# Altium footprint library xcvu351.PcbLib: 27 footprints (part 3 of 4)
Each footprint in its own frame and in the unit in brackets; x right, y up, seen from the top. Pads: shape width x height; smd on the part's side, far side on the other; paste and mask are expansions set on the pad; w line width, h text height; cw(c..) or ccw(c..) is an arc to the next point about the centre after c.
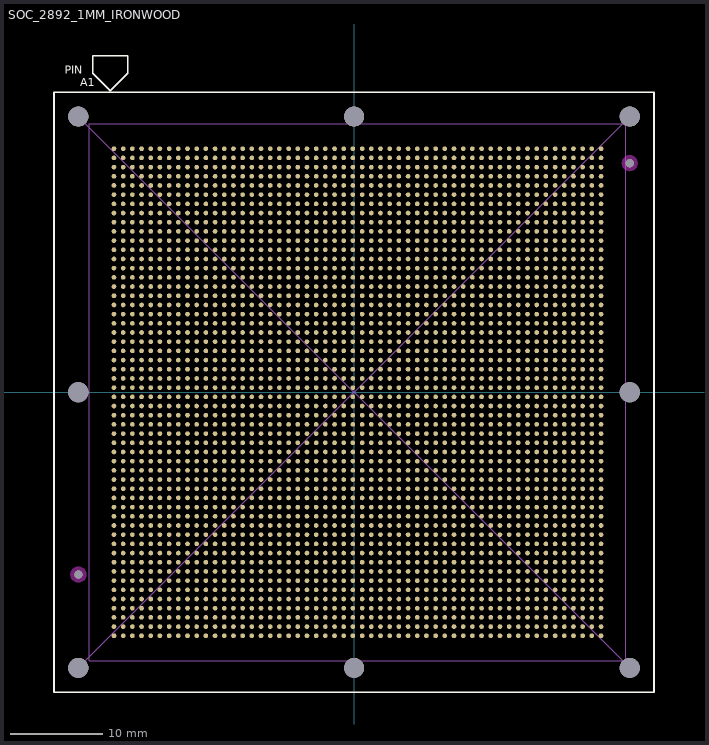
[diagram p2: the footprint, top view; thin cyan lines are the x and y axes]

## SOC_2892_1MM_IRONWOOD [mil] "SOC_2892_1MM_IRONWOOD"
pads (2926):
  round 20 smd: A4(-910.2,1043.31) A5(-870.83,1043.31) A6(-831.46,1043.31) A7(-792.09,1043.31) A8(-752.72,1043.31) A9(-713.35,1043.31) A10(-673.98,1043.31) A11(-634.61,1043.31) A12(-595.24,1043.31) A13(-555.87,1043.31) A14(-516.5,1043.31) A15(-477.13,1043.31) A16(-437.76,1043.31) A17(-398.39,1043.31) A18(-359.02,1043.31) A19(-319.65,1043.31) A20(-280.28,1043.31) A21(-240.91,1043.31) A22(-201.53,1043.31) A23(-162.16,1043.31) A24(-122.8,1043.31) A25(-83.42,1043.31) A26(-44.05,1043.31) A27(-4.68,1043.31) A28(34.69,1043.31) A29(74.06,1043.31) A30(113.42,1043.31) A31(152.79,1043.31) A32(192.16,1043.31) A33(231.53,1043.31) A34(270.91,1043.31) A35(310.28,1043.31) A36(349.65,1043.31) A37(389.02,1043.31) A38(428.39,1043.31) A39(467.76,1043.31) A40(507.13,1043.31) A41(546.5,1043.31) A42(585.87,1043.31) A43(625.24,1043.31) A44(664.61,1043.31) A45(703.98,1043.31) A46(743.35,1043.31) A47(782.72,1043.31) A48(822.09,1043.31) A49(861.46,1043.31) A50(900.83,1043.31) A51(940.2,1043.31) AA1(-1028.31,255.91) AA2(-988.94,255.91) AA3(-949.57,255.91) AA4(-910.2,255.91) AA5(-870.83,255.91) AA6(-831.46,255.91) AA7(-792.09,255.91) AA8(-752.72,255.91) AA9(-713.35,255.91) AA10(-673.98,255.91) AA11(-634.61,255.91) AA12(-595.24,255.91) AA13(-555.87,255.91) AA14(-516.5,255.91) AA15(-477.13,255.91) AA16(-437.76,255.91) AA17(-398.39,255.91) AA18(-359.02,255.91) AA19(-319.65,255.91) AA20(-280.28,255.91) AA21(-240.91,255.91) AA22(-201.53,255.91) AA23(-162.16,255.91) AA24(-122.8,255.91) AA25(-83.42,255.91) AA26(-44.05,255.91) AA27(-4.68,255.91) AA28(34.69,255.91) AA29(74.06,255.91) AA30(113.42,255.91) AA31(152.79,255.91) AA32(192.16,255.91) AA33(231.53,255.91) AA34(270.91,255.91) AA35(310.28,255.91) AA36(349.65,255.91) AA37(389.02,255.91) AA38(428.39,255.91) AA39(467.76,255.91) AA40(507.13,255.91) AA41(546.5,255.91) AA42(585.87,255.91) AA43(625.24,255.91) AA44(664.61,255.91) AA45(703.98,255.91) AA46(743.35,255.91) AA47(782.72,255.91) AA48(822.09,255.91) AA49(861.46,255.91) AA50(900.83,255.91) AA51(940.2,255.91) AA52(979.57,255.91) AA53(1018.94,255.91) AA54(1058.31,255.91) AB1(-1028.31,216.53) AB2(-988.94,216.53) AB3(-949.57,216.53) AB4(-910.2,216.53) AB5(-870.83,216.53) AB6(-831.46,216.53) AB7(-792.09,216.53) AB8(-752.72,216.53) AB9(-713.35,216.53) AB10(-673.98,216.53) AB11(-634.61,216.53) AB12(-595.24,216.53) AB13(-555.87,216.53) AB14(-516.5,216.53) AB15(-477.13,216.53) AB16(-437.76,216.53) AB17(-398.39,216.53) AB18(-359.02,216.53) AB19(-319.65,216.53) AB20(-280.28,216.53) AB21(-240.91,216.53) AB22(-201.53,216.53) AB23(-162.16,216.53) AB24(-122.8,216.53) AB25(-83.42,216.53) AB26(-44.05,216.53) AB27(-4.68,216.53) AB28(34.69,216.53) AB29(74.06,216.53) AB30(113.42,216.53) AB31(152.79,216.53) AB32(192.16,216.53) AB33(231.53,216.53) AB34(270.91,216.53) AB35(310.28,216.53) AB36(349.65,216.53) AB37(389.02,216.53) AB38(428.39,216.53) AB39(467.76,216.53) AB40(507.13,216.53) AB41(546.5,216.53) AB42(585.87,216.53) AB43(625.24,216.53) AB44(664.61,216.53) AB45(703.98,216.53) AB46(743.35,216.53) AB47(782.72,216.53) AB48(822.09,216.53) AB49(861.46,216.53) AB50(900.83,216.53) AB51(940.2,216.53) AB52(979.57,216.53) AB53(1018.94,216.53) AB54(1058.31,216.53) AC1(-1028.31,177.16) AC2(-988.94,177.16) AC3(-949.57,177.16) AC4(-910.2,177.16) AC5(-870.83,177.16) AC6(-831.46,177.16) AC7(-792.09,177.16) AC8(-752.72,177.16) AC9(-713.35,177.16) AC10(-673.98,177.16) AC11(-634.61,177.16) AC12(-595.24,177.16) AC13(-555.87,177.16) AC14(-516.5,177.16) AC15(-477.13,177.16) AC16(-437.76,177.16) AC17(-398.39,177.16) AC18(-359.02,177.16) AC19(-319.65,177.16) AC20(-280.28,177.16) AC21(-240.91,177.16) AC22(-201.53,177.16) AC23(-162.16,177.16) AC24(-122.8,177.16) AC25(-83.42,177.16) AC26(-44.05,177.16) AC27(-4.68,177.16) AC28(34.69,177.16) AC29(74.06,177.16) AC30(113.42,177.16) AC31(152.79,177.16) AC32(192.16,177.16) AC33(231.53,177.16) AC34(270.91,177.16) AC35(310.28,177.16) AC36(349.65,177.16) AC37(389.02,177.16) AC38(428.39,177.16) AC39(467.76,177.16) AC40(507.13,177.16) AC41(546.5,177.16) AC42(585.87,177.16) AC43(625.24,177.16) AC44(664.61,177.16) AC45(703.98,177.16) AC46(743.35,177.16) AC47(782.72,177.16) AC48(822.09,177.16) AC49(861.46,177.16) AC50(900.83,177.16) AC51(940.2,177.16) AC52(979.57,177.16) AC53(1018.94,177.16) AC54(1058.31,177.16) AD1(-1028.31,137.79) AD2(-988.94,137.79) AD3(-949.57,137.79) AD4(-910.2,137.79) AD5(-870.83,137.79) AD6(-831.46,137.79) AD7(-792.09,137.79) AD8(-752.72,137.79) AD9(-713.35,137.79) AD10(-673.98,137.79) AD11(-634.61,137.79) AD12(-595.24,137.79) AD13(-555.87,137.79) AD14(-516.5,137.79) AD15(-477.13,137.79) AD16(-437.76,137.79) AD17(-398.39,137.79) AD18(-359.02,137.79) AD19(-319.65,137.79) AD20(-280.28,137.79) AD21(-240.91,137.79) AD22(-201.53,137.79) AD23(-162.16,137.79) AD24(-122.8,137.79) AD25(-83.42,137.79) AD26(-44.05,137.79) AD27(-4.68,137.79) AD28(34.69,137.79) AD29(74.06,137.79) AD30(113.42,137.79) AD31(152.79,137.79) AD32(192.16,137.79) AD33(231.53,137.79) AD34(270.91,137.79) AD35(310.28,137.79) AD36(349.65,137.79) AD37(389.02,137.79) AD38(428.39,137.79) AD39(467.76,137.79) AD40(507.13,137.79) AD41(546.5,137.79) AD42(585.87,137.79) AD43(625.24,137.79) AD44(664.61,137.79) AD45(703.98,137.79) AD46(743.35,137.79) AD47(782.72,137.79) AD48(822.09,137.79) AD49(861.46,137.79) AD50(900.83,137.79) AD51(940.2,137.79) AD52(979.57,137.79) AD53(1018.94,137.79) AD54(1058.31,137.79) AE1(-1028.31,98.42) AE2(-988.94,98.42) AE3(-949.57,98.42) AE4(-910.2,98.42) AE5(-870.83,98.42) AE6(-831.46,98.42) AE7(-792.09,98.42) AE8(-752.72,98.42) AE9(-713.35,98.42) AE10(-673.98,98.42) AE11(-634.61,98.42) AE12(-595.24,98.42) AE13(-555.87,98.42) AE14(-516.5,98.42) AE15(-477.13,98.42) AE16(-437.76,98.42) AE17(-398.39,98.42) AE18(-359.02,98.42) AE19(-319.65,98.42) AE20(-280.28,98.42) AE21(-240.91,98.42) AE22(-201.53,98.42) AE23(-162.16,98.42) AE24(-122.8,98.42) AE25(-83.42,98.42) AE26(-44.05,98.42) AE27(-4.68,98.42) AE28(34.69,98.42) AE29(74.06,98.42) AE30(113.42,98.42) AE31(152.79,98.42) AE32(192.16,98.42) AE33(231.53,98.42) AE34(270.91,98.42) AE35(310.28,98.42) AE36(349.65,98.42) AE37(389.02,98.42) AE38(428.39,98.42) AE39(467.76,98.42) AE40(507.13,98.42) AE41(546.5,98.42) AE42(585.87,98.42) AE43(625.24,98.42) AE44(664.61,98.42) AE45(703.98,98.42) AE46(743.35,98.42) AE47(782.72,98.42) AE48(822.09,98.42) AE49(861.46,98.42) AE50(900.83,98.42) AE51(940.2,98.42) AE52(979.57,98.42) AE53(1018.94,98.42) AE54(1058.31,98.42) AF1(-1028.31,59.05) AF2(-988.94,59.05) AF3(-949.57,59.05) AF4(-910.2,59.05) AF5(-870.83,59.05) AF6(-831.46,59.05) AF7(-792.09,59.05) AF8(-752.72,59.05) AF9(-713.35,59.05) AF10(-673.98,59.05) AF11(-634.61,59.05) AF12(-595.24,59.05) AF13(-555.87,59.05) AF14(-516.5,59.05) AF15(-477.13,59.05) AF16(-437.76,59.05) AF17(-398.39,59.05) AF18(-359.02,59.05) AF19(-319.65,59.05) AF20(-280.28,59.05) AF21(-240.91,59.05) AF22(-201.53,59.05) AF23(-162.16,59.05) AF24(-122.8,59.05) AF25(-83.42,59.05) AF26(-44.05,59.05) AF27(-4.68,59.05) AF28(34.69,59.05) AF29(74.06,59.05) AF30(113.42,59.05) AF31(152.79,59.05) AF32(192.16,59.05) AF33(231.53,59.05) AF34(270.91,59.05) AF35(310.28,59.05) AF36(349.65,59.05) AF37(389.02,59.05) AF38(428.39,59.05) AF39(467.76,59.05) AF40(507.13,59.05) AF41(546.5,59.05) AF42(585.87,59.05) AF43(625.24,59.05) AF44(664.61,59.05) AF45(703.98,59.05) AF46(743.35,59.05) AF47(782.72,59.05) AF48(822.09,59.05) AF49(861.46,59.05) AF50(900.83,59.05) AF51(940.2,59.05) AF52(979.57,59.05) AF53(1018.94,59.05) AF54(1058.31,59.05) AG1(-1028.31,19.68) AG2(-988.94,19.68) AG3(-949.57,19.68) AG4(-910.2,19.68) AG5(-870.83,19.68) AG6(-831.46,19.68) AG7(-792.09,19.68) AG8(-752.72,19.68) AG9(-713.35,19.68) AG10(-673.98,19.68) AG11(-634.61,19.68) AG12(-595.24,19.68) AG13(-555.87,19.68) AG14(-516.5,19.68) AG15(-477.13,19.68) AG16(-437.76,19.68) AG17(-398.39,19.68) AG18(-359.02,19.68) AG19(-319.65,19.68) AG20(-280.28,19.68) AG21(-240.91,19.68) AG22(-201.53,19.68) AG23(-162.16,19.68) AG24(-122.8,19.68) AG25(-83.42,19.68) AG26(-44.05,19.68) AG27(-4.68,19.68) AG28(34.69,19.68) AG29(74.06,19.68) AG30(113.42,19.68) AG31(152.79,19.68) AG32(192.16,19.68) AG33(231.53,19.68) AG34(270.91,19.68) AG35(310.28,19.68) AG36(349.65,19.68) AG37(389.02,19.68) AG38(428.39,19.68) AG39(467.76,19.68) AG40(507.13,19.68) AG41(546.5,19.68) AG42(585.87,19.68) AG43(625.24,19.68) AG44(664.61,19.68) AG45(703.98,19.68) AG46(743.35,19.68) AG47(782.72,19.68) AG48(822.09,19.68) AG49(861.46,19.68) AG50(900.83,19.68) AG51(940.2,19.68) AG52(979.57,19.68) AG53(1018.94,19.68) AG54(1058.31,19.68) AH1(-1028.31,-19.68) AH2(-988.94,-19.68) AH3(-949.57,-19.68) AH4(-910.2,-19.68) AH5(-870.83,-19.68) AH6(-831.46,-19.68) AH7(-792.09,-19.68) AH8(-752.72,-19.68) AH9(-713.35,-19.68) AH10(-673.98,-19.68) AH11(-634.61,-19.68) AH12(-595.24,-19.68) AH13(-555.87,-19.68) AH14(-516.5,-19.68) AH15(-477.13,-19.68) AH16(-437.76,-19.68) AH17(-398.39,-19.68) AH18(-359.02,-19.68) AH19(-319.65,-19.68) AH20(-280.28,-19.68) AH21(-240.91,-19.68) AH22(-201.53,-19.68) AH23(-162.16,-19.68) AH24(-122.8,-19.68) AH25(-83.42,-19.68) AH26(-44.05,-19.68) AH27(-4.68,-19.68) AH28(34.69,-19.68) AH29(74.06,-19.68) AH30(113.42,-19.68) AH31(152.79,-19.68) AH32(192.16,-19.68) AH33(231.53,-19.68) AH34(270.91,-19.68) AH35(310.28,-19.68) AH36(349.65,-19.68) AH37(389.02,-19.68) AH38(428.39,-19.68) AH39(467.76,-19.68) AH40(507.13,-19.68) AH41(546.5,-19.68) AH42(585.87,-19.68) AH43(625.24,-19.68) AH44(664.61,-19.68) AH45(703.98,-19.68) AH46(743.35,-19.68) AH47(782.72,-19.68) AH48(822.09,-19.68) AH49(861.46,-19.68) AH50(900.83,-19.68) AH51(940.2,-19.68) AH52(979.57,-19.68) AH53(1018.94,-19.68) AH54(1058.31,-19.68) AJ1(-1028.31,-59.05) AJ2(-988.94,-59.05) AJ3(-949.57,-59.05) AJ4(-910.2,-59.05) AJ5(-870.83,-59.05) AJ6(-831.46,-59.05) AJ7(-792.09,-59.05) AJ8(-752.72,-59.05) AJ9(-713.35,-59.05) AJ10(-673.98,-59.05) AJ11(-634.61,-59.05) AJ12(-595.24,-59.05) AJ13(-555.87,-59.05) AJ14(-516.5,-59.05) AJ15(-477.13,-59.05) AJ16(-437.76,-59.05) AJ17(-398.39,-59.05) AJ18(-359.02,-59.05) AJ19(-319.65,-59.05) AJ20(-280.28,-59.05) AJ21(-240.91,-59.05) AJ22(-201.53,-59.05) AJ23(-162.16,-59.05) AJ24(-122.8,-59.05) AJ25(-83.42,-59.05) AJ26(-44.05,-59.05) AJ27(-4.68,-59.05) AJ28(34.69,-59.05) AJ29(74.06,-59.05) AJ30(113.42,-59.05) AJ31(152.79,-59.05) AJ32(192.16,-59.05) AJ33(231.53,-59.05) AJ34(270.91,-59.05) AJ35(310.28,-59.05) AJ36(349.65,-59.05) AJ37(389.02,-59.05) AJ38(428.39,-59.05) AJ39(467.76,-59.05) AJ40(507.13,-59.05) AJ41(546.5,-59.05) AJ42(585.87,-59.05) AJ43(625.24,-59.05) AJ44(664.61,-59.05) AJ45(703.98,-59.05) AJ46(743.35,-59.05) AJ47(782.72,-59.05) AJ48(822.09,-59.05) AJ49(861.46,-59.05) AJ50(900.83,-59.05) AJ51(940.2,-59.05) AJ52(979.57,-59.05) AJ53(1018.94,-59.05) AJ54(1058.31,-59.05) AK1(-1028.31,-98.42) AK2(-988.94,-98.42) AK3(-949.57,-98.42) AK4(-910.2,-98.42) AK5(-870.83,-98.42) AK6(-831.46,-98.42) AK7(-792.09,-98.42) AK8(-752.72,-98.42) AK9(-713.35,-98.42) AK10(-673.98,-98.42) AK11(-634.61,-98.42) AK12(-595.24,-98.42) AK13(-555.87,-98.42) AK14(-516.5,-98.42) AK15(-477.13,-98.42) AK16(-437.76,-98.42) AK17(-398.39,-98.42) AK18(-359.02,-98.42) AK19(-319.65,-98.42) AK20(-280.28,-98.42) AK21(-240.91,-98.42) AK22(-201.53,-98.42) AK23(-162.16,-98.42) AK24(-122.8,-98.42) AK25(-83.42,-98.42) AK26(-44.05,-98.42) AK27(-4.68,-98.42) AK28(34.69,-98.42) AK29(74.06,-98.42) AK30(113.42,-98.42) AK31(152.79,-98.42) AK32(192.16,-98.42) AK33(231.53,-98.42) AK34(270.91,-98.42) AK35(310.28,-98.42) AK36(349.65,-98.42) AK37(389.02,-98.42) AK38(428.39,-98.42) AK39(467.76,-98.42) AK40(507.13,-98.42) AK41(546.5,-98.42) AK42(585.87,-98.42) AK43(625.24,-98.42) AK44(664.61,-98.42) AK45(703.98,-98.42) AK46(743.35,-98.42) AK47(782.72,-98.42) AK48(822.09,-98.42) AK49(861.46,-98.42) AK50(900.83,-98.42) AK51(940.2,-98.42) AK52(979.57,-98.42) AK53(1018.94,-98.42) AK54(1058.31,-98.42) AL1(-1028.31,-137.79) AL2(-988.94,-137.79) AL3(-949.57,-137.79) AL4(-910.2,-137.79) AL5(-870.83,-137.79) AL6(-831.46,-137.79) AL7(-792.09,-137.79) AL8(-752.72,-137.79) AL9(-713.35,-137.79) AL10(-673.98,-137.79) AL11(-634.61,-137.79) AL12(-595.24,-137.79) AL13(-555.87,-137.79) AL14(-516.5,-137.79) AL15(-477.13,-137.79) AL16(-437.76,-137.79) AL17(-398.39,-137.79) AL18(-359.02,-137.79) AL19(-319.65,-137.79) AL20(-280.28,-137.79) AL21(-240.91,-137.79) AL22(-201.53,-137.79) AL23(-162.16,-137.79) AL24(-122.8,-137.79) AL25(-83.42,-137.79) AL26(-44.05,-137.79) AL27(-4.68,-137.79) AL28(34.69,-137.79) AL29(74.06,-137.79) AL30(113.42,-137.79) AL31(152.79,-137.79) AL32(192.16,-137.79) AL33(231.53,-137.79) AL34(270.91,-137.79) AL35(310.28,-137.79) AL36(349.65,-137.79) AL37(389.02,-137.79) AL38(428.39,-137.79) AL39(467.76,-137.79) AL40(507.13,-137.79) AL41(546.5,-137.79) AL42(585.87,-137.79) AL43(625.24,-137.79) AL44(664.61,-137.79) AL45(703.98,-137.79) AL46(743.35,-137.79) AL47(782.72,-137.79) AL48(822.09,-137.79) AL49(861.46,-137.79) AL50(900.83,-137.79) AL51(940.2,-137.79) AL52(979.57,-137.79) AL53(1018.94,-137.79) AL54(1058.31,-137.79) AM1(-1028.31,-177.16) AM2(-988.94,-177.16) AM3(-949.57,-177.16) AM4(-910.2,-177.16) AM5(-870.83,-177.16) AM6(-831.46,-177.16) AM7(-792.09,-177.16) AM8(-752.72,-177.16) AM9(-713.35,-177.16) AM10(-673.98,-177.16) AM11(-634.61,-177.16) AM12(-595.24,-177.16) AM13(-555.87,-177.16) AM14(-516.5,-177.16) AM15(-477.13,-177.16) AM16(-437.76,-177.16) AM17(-398.39,-177.16) AM18(-359.02,-177.16) AM19(-319.65,-177.16) AM20(-280.28,-177.16) AM21(-240.91,-177.16) AM22(-201.53,-177.16) AM23(-162.16,-177.16) AM24(-122.8,-177.16) AM25(-83.42,-177.16) AM26(-44.05,-177.16) AM27(-4.68,-177.16) AM28(34.69,-177.16) AM29(74.06,-177.16) AM30(113.42,-177.16) AM31(152.79,-177.16) AM32(192.16,-177.16) AM33(231.53,-177.16) AM34(270.91,-177.16) AM35(310.28,-177.16) AM36(349.65,-177.16) AM37(389.02,-177.16) AM38(428.39,-177.16) AM39(467.76,-177.16) AM40(507.13,-177.16) AM41(546.5,-177.16) AM42(585.87,-177.16) AM43(625.24,-177.16) AM44(664.61,-177.16) AM45(703.98,-177.16) AM46(743.35,-177.16) AM47(782.72,-177.16) AM48(822.09,-177.16) AM49(861.46,-177.16) AM50(900.83,-177.16) AM51(940.2,-177.16) AM52(979.57,-177.16) AM53(1018.94,-177.16) AM54(1058.31,-177.16) AN1(-1028.31,-216.53) AN2(-988.94,-216.53) AN3(-949.57,-216.53) AN4(-910.2,-216.53) AN5(-870.83,-216.53) AN6(-831.46,-216.53) AN7(-792.09,-216.53) AN8(-752.72,-216.53) AN9(-713.35,-216.53) AN10(-673.98,-216.53) AN11(-634.61,-216.53) AN12(-595.24,-216.53) AN13(-555.87,-216.53) AN14(-516.5,-216.53) AN15(-477.13,-216.53) AN16(-437.76,-216.53) AN17(-398.39,-216.53) AN18(-359.02,-216.53) AN19(-319.65,-216.53) AN20(-280.28,-216.53) AN21(-240.91,-216.53) AN22(-201.53,-216.53) AN23(-162.16,-216.53) AN24(-122.8,-216.53) AN25(-83.42,-216.53) AN26(-44.05,-216.53) AN27(-4.68,-216.53) AN28(34.69,-216.53) AN29(74.06,-216.53) AN30(113.42,-216.53) AN31(152.79,-216.53) AN32(192.16,-216.53) AN33(231.53,-216.53) AN34(270.91,-216.53) AN35(310.28,-216.53) AN36(349.65,-216.53) AN37(389.02,-216.53) AN38(428.39,-216.53) AN39(467.76,-216.53) AN40(507.13,-216.53) AN41(546.5,-216.53) AN42(585.87,-216.53) AN43(625.24,-216.53) AN44(664.61,-216.53) AN45(703.98,-216.53) AN46(743.35,-216.53) AN47(782.72,-216.53) AN48(822.09,-216.53) AN49(861.46,-216.53) AN50(900.83,-216.53) AN51(940.2,-216.53) AN52(979.57,-216.53) AN53(1018.94,-216.53) AN54(1058.31,-216.53) AP1(-1028.31,-255.91) AP2(-988.94,-255.91) AP3(-949.57,-255.91) AP4(-910.2,-255.91) AP5(-870.83,-255.91) AP6(-831.46,-255.91) AP7(-792.09,-255.91) AP8(-752.72,-255.91) AP9(-713.35,-255.91) AP10(-673.98,-255.91) AP11(-634.61,-255.91) AP12(-595.24,-255.91) AP13(-555.87,-255.91) AP14(-516.5,-255.91) AP15(-477.13,-255.91) AP16(-437.76,-255.91) AP17(-398.39,-255.91) AP18(-359.02,-255.91) AP19(-319.65,-255.91) AP20(-280.28,-255.91) AP21(-240.91,-255.91) AP22(-201.53,-255.91) AP23(-162.16,-255.91) AP24(-122.8,-255.91) AP25(-83.42,-255.91) AP26(-44.05,-255.91) AP27(-4.68,-255.91) AP28(34.69,-255.91) AP29(74.06,-255.91) AP30(113.42,-255.91) AP31(152.79,-255.91) AP32(192.16,-255.91) AP33(231.53,-255.91) AP34(270.91,-255.91) AP35(310.28,-255.91) AP36(349.65,-255.91) AP37(389.02,-255.91) AP38(428.39,-255.91) AP39(467.76,-255.91) AP40(507.13,-255.91) AP41(546.5,-255.91) AP42(585.87,-255.91) AP43(625.24,-255.91) AP44(664.61,-255.91) AP45(703.98,-255.91) AP46(743.35,-255.91) AP47(782.72,-255.91) AP48(822.09,-255.91) AP49(861.46,-255.91) AP50(900.83,-255.91) AP51(940.2,-255.91) AP52(979.57,-255.91) AP53(1018.94,-255.91) AP54(1058.31,-255.91) AR1(-1028.31,-295.28) AR2(-988.94,-295.28) AR3(-949.57,-295.28) AR4(-910.2,-295.28) AR5(-870.83,-295.28) AR6(-831.46,-295.28) AR7(-792.09,-295.28) AR8(-752.72,-295.28) AR9(-713.35,-295.28) AR10(-673.98,-295.28) AR11(-634.61,-295.28) AR12(-595.24,-295.28) AR13(-555.87,-295.28) AR14(-516.5,-295.28) AR15(-477.13,-295.28) AR16(-437.76,-295.28) AR17(-398.39,-295.28) AR18(-359.02,-295.28) AR19(-319.65,-295.28) AR20(-280.28,-295.28) AR21(-240.91,-295.28) AR22(-201.53,-295.28) AR23(-162.16,-295.28) AR24(-122.8,-295.28) AR25(-83.42,-295.28) AR26(-44.05,-295.28) AR27(-4.68,-295.28) AR28(34.69,-295.28) AR29(74.06,-295.28) AR30(113.42,-295.28) AR31(152.79,-295.28) AR32(192.16,-295.28) AR33(231.53,-295.28) AR34(270.91,-295.28) AR35(310.28,-295.28) AR36(349.65,-295.28) AR37(389.02,-295.28) AR38(428.39,-295.28) AR39(467.76,-295.28) AR40(507.13,-295.28) AR41(546.5,-295.28) AR42(585.87,-295.28) AR43(625.24,-295.28) AR44(664.61,-295.28) AR45(703.98,-295.28) AR46(743.35,-295.28) AR47(782.72,-295.28) AR48(822.09,-295.28) AR49(861.46,-295.28) AR50(900.83,-295.28) AR51(940.2,-295.28) AR52(979.57,-295.28) AR53(1018.94,-295.28) AR54(1058.31,-295.28) AT1(-1028.31,-334.65) AT2(-988.94,-334.65) AT3(-949.57,-334.65) AT4(-910.2,-334.65) AT5(-870.83,-334.65) AT6(-831.46,-334.65) AT7(-792.09,-334.65) AT8(-752.72,-334.65) AT9(-713.35,-334.65) AT10(-673.98,-334.65) AT11(-634.61,-334.65) AT12(-595.24,-334.65) AT13(-555.87,-334.65) AT14(-516.5,-334.65) AT15(-477.13,-334.65) AT16(-437.76,-334.65) AT17(-398.39,-334.65) AT18(-359.02,-334.65) AT19(-319.65,-334.65) AT20(-280.28,-334.65) AT21(-240.91,-334.65) AT22(-201.53,-334.65) AT23(-162.16,-334.65) AT24(-122.8,-334.65) AT25(-83.42,-334.65) AT26(-44.05,-334.65) AT27(-4.68,-334.65) AT28(34.69,-334.65) AT29(74.06,-334.65) AT30(113.42,-334.65) AT31(152.79,-334.65) AT32(192.16,-334.65) AT33(231.53,-334.65) AT34(270.91,-334.65) AT35(310.28,-334.65) AT36(349.65,-334.65) AT37(389.02,-334.65) AT38(428.39,-334.65) AT39(467.76,-334.65) AT40(507.13,-334.65) AT41(546.5,-334.65) AT42(585.87,-334.65) AT43(625.24,-334.65) AT44(664.61,-334.65) AT45(703.98,-334.65) AT46(743.35,-334.65) AT47(782.72,-334.65) AT48(822.09,-334.65) AT49(861.46,-334.65) AT50(900.83,-334.65) AT51(940.2,-334.65) AT52(979.57,-334.65) AT53(1018.94,-334.65) AT54(1058.31,-334.65) AU1(-1028.31,-374.02) AU2(-988.94,-374.02) AU3(-949.57,-374.02) AU4(-910.2,-374.02) AU5(-870.83,-374.02) AU6(-831.46,-374.02) AU7(-792.09,-374.02) AU8(-752.72,-374.02) AU9(-713.35,-374.02) AU10(-673.98,-374.02) AU11(-634.61,-374.02) AU12(-595.24,-374.02) AU13(-555.87,-374.02) AU14(-516.5,-374.02) AU15(-477.13,-374.02) AU16(-437.76,-374.02) AU17(-398.39,-374.02) AU18(-359.02,-374.02) AU19(-319.65,-374.02) AU20(-280.28,-374.02) AU21(-240.91,-374.02) AU22(-201.53,-374.02) AU23(-162.16,-374.02) AU24(-122.8,-374.02) AU25(-83.42,-374.02) AU26(-44.05,-374.02) AU27(-4.68,-374.02) AU28(34.69,-374.02) AU29(74.06,-374.02) AU30(113.42,-374.02) AU31(152.79,-374.02) AU32(192.16,-374.02) AU33(231.53,-374.02) AU34(270.91,-374.02) AU35(310.28,-374.02) AU36(349.65,-374.02) AU37(389.02,-374.02) AU38(428.39,-374.02) AU39(467.76,-374.02) AU40(507.13,-374.02) AU41(546.5,-374.02) AU42(585.87,-374.02) AU43(625.24,-374.02) AU44(664.61,-374.02) AU45(703.98,-374.02) AU46(743.35,-374.02) AU47(782.72,-374.02) AU48(822.09,-374.02) AU49(861.46,-374.02) AU50(900.83,-374.02) AU51(940.2,-374.02) AU52(979.57,-374.02) AU53(1018.94,-374.02) AU54(1058.31,-374.02) AV1(-1028.31,-413.39) AV2(-988.94,-413.39) AV3(-949.57,-413.39) AV4(-910.2,-413.39) AV5(-870.83,-413.39) AV6(-831.46,-413.39) AV7(-792.09,-413.39) AV8(-752.72,-413.39) AV9(-713.35,-413.39) AV10(-673.98,-413.39) AV11(-634.61,-413.39) AV12(-595.24,-413.39) AV13(-555.87,-413.39) AV14(-516.5,-413.39) AV15(-477.13,-413.39) AV16(-437.76,-413.39) AV17(-398.39,-413.39) AV18(-359.02,-413.39) AV19(-319.65,-413.39) AV20(-280.28,-413.39) AV21(-240.91,-413.39) AV22(-201.53,-413.39) AV23(-162.16,-413.39) AV24(-122.8,-413.39) AV25(-83.42,-413.39) AV26(-44.05,-413.39) AV27(-4.68,-413.39) AV28(34.69,-413.39) AV29(74.06,-413.39) AV30(113.42,-413.39) AV31(152.79,-413.39) AV32(192.16,-413.39) AV33(231.53,-413.39) AV34(270.91,-413.39) AV35(310.28,-413.39) AV36(349.65,-413.39) AV37(389.02,-413.39) AV38(428.39,-413.39) AV39(467.76,-413.39) AV40(507.13,-413.39) AV41(546.5,-413.39) AV42(585.87,-413.39) AV43(625.24,-413.39) AV44(664.61,-413.39) AV45(703.98,-413.39) AV46(743.35,-413.39) AV47(782.72,-413.39) AV48(822.09,-413.39) AV49(861.46,-413.39) AV50(900.83,-413.39) AV51(940.2,-413.39) AV52(979.57,-413.39) AV53(1018.94,-413.39) AV54(1058.31,-413.39) AW1(-1028.31,-452.76) AW2(-988.94,-452.76) AW3(-949.57,-452.76) AW4(-910.2,-452.76) AW5(-870.83,-452.76) AW6(-831.46,-452.76) AW7(-792.09,-452.76) AW8(-752.72,-452.76) AW9(-713.35,-452.76) AW10(-673.98,-452.76) AW11(-634.61,-452.76) AW12(-595.24,-452.76) AW13(-555.87,-452.76) AW14(-516.5,-452.76) AW15(-477.13,-452.76) AW16(-437.76,-452.76) AW17(-398.39,-452.76) AW18(-359.02,-452.76) AW19(-319.65,-452.76) AW20(-280.28,-452.76) AW21(-240.91,-452.76) AW22(-201.53,-452.76) AW23(-162.16,-452.76) AW24(-122.8,-452.76) AW25(-83.42,-452.76) AW26(-44.05,-452.76) AW27(-4.68,-452.76) AW28(34.69,-452.76) AW29(74.06,-452.76) AW30(113.42,-452.76) AW31(152.79,-452.76) AW32(192.16,-452.76) AW33(231.53,-452.76) AW34(270.91,-452.76) AW35(310.28,-452.76) AW36(349.65,-452.76) AW37(389.02,-452.76) AW38(428.39,-452.76) AW39(467.76,-452.76) AW40(507.13,-452.76) AW41(546.5,-452.76) AW42(585.87,-452.76) AW43(625.24,-452.76) AW44(664.61,-452.76) AW45(703.98,-452.76) AW46(743.35,-452.76) AW47(782.72,-452.76) AW48(822.09,-452.76) AW49(861.46,-452.76) AW50(900.83,-452.76) AW51(940.2,-452.76) AW52(979.57,-452.76) AW53(1018.94,-452.76) AW54(1058.31,-452.76) AY1(-1028.31,-492.13) AY2(-988.94,-492.13) AY3(-949.57,-492.13) AY4(-910.2,-492.13) AY5(-870.83,-492.13) AY6(-831.46,-492.13) AY7(-792.09,-492.13) AY8(-752.72,-492.13) AY9(-713.35,-492.13) AY10(-673.98,-492.13) AY11(-634.61,-492.13) AY12(-595.24,-492.13) AY13(-555.87,-492.13) AY14(-516.5,-492.13) AY15(-477.13,-492.13) AY16(-437.76,-492.13) AY17(-398.39,-492.13) AY18(-359.02,-492.13) AY19(-319.65,-492.13) AY20(-280.28,-492.13) AY21(-240.91,-492.13) AY22(-201.53,-492.13) AY23(-162.16,-492.13) AY24(-122.8,-492.13) AY25(-83.42,-492.13) AY26(-44.05,-492.13) AY27(-4.68,-492.13) AY28(34.69,-492.13) AY29(74.06,-492.13) AY30(113.42,-492.13) AY31(152.79,-492.13) AY32(192.16,-492.13) AY33(231.53,-492.13) AY34(270.91,-492.13) AY35(310.28,-492.13) AY36(349.65,-492.13) AY37(389.02,-492.13) AY38(428.39,-492.13) AY39(467.76,-492.13) AY40(507.13,-492.13) AY41(546.5,-492.13) AY42(585.87,-492.13) AY43(625.24,-492.13) AY44(664.61,-492.13) AY45(703.98,-492.13) AY46(743.35,-492.13) AY47(782.72,-492.13) AY48(822.09,-492.13) AY49(861.46,-492.13) AY50(900.83,-492.13) AY51(940.2,-492.13) AY52(979.57,-492.13) AY53(1018.94,-492.13) AY54(1058.31,-492.13) B3(-949.57,1003.94) B4(-910.2,1003.94) B5(-870.83,1003.94) B6(-831.46,1003.94) B7(-792.09,1003.94) B8(-752.72,1003.94) B9(-713.35,1003.94) B10(-673.98,1003.94) B11(-634.61,1003.94) B12(-595.24,1003.94) B13(-555.87,1003.94) B14(-516.5,1003.94) B15(-477.13,1003.94) B16(-437.76,1003.94) B17(-398.39,1003.94) B18(-359.02,1003.94) B19(-319.65,1003.94) B20(-280.28,1003.94) B21(-240.91,1003.94) B22(-201.53,1003.94) B23(-162.16,1003.94) B24(-122.8,1003.94) B25(-83.42,1003.94) B26(-44.05,1003.94) B27(-4.68,1003.94) B28(34.69,1003.94) B29(74.06,1003.94) B30(113.42,1003.94) B31(152.79,1003.94) B32(192.16,1003.94) B33(231.53,1003.94) B34(270.91,1003.94) B35(310.28,1003.94) B36(349.65,1003.94) B37(389.02,1003.94) B38(428.39,1003.94) B39(467.76,1003.94) B40(507.13,1003.94) B41(546.5,1003.94) B42(585.87,1003.94) B43(625.24,1003.94) B44(664.61,1003.94) B45(703.98,1003.94) B46(743.35,1003.94) B47(782.72,1003.94) B48(822.09,1003.94) B49(861.46,1003.94) B50(900.83,1003.94) B51(940.2,1003.94) B52(979.57,1003.94) BA1(-1028.31,-531.5) BA2(-988.94,-531.5) BA3(-949.57,-531.5) BA4(-910.2,-531.5) BA5(-870.83,-531.5) BA6(-831.46,-531.5) BA7(-792.09,-531.5) BA8(-752.72,-531.5) BA9(-713.35,-531.5) BA10(-673.98,-531.5) BA11(-634.61,-531.5) BA12(-595.24,-531.5) BA13(-555.87,-531.5) BA14(-516.5,-531.5) BA15(-477.13,-531.5) BA16(-437.76,-531.5) BA17(-398.39,-531.5) BA18(-359.02,-531.5) BA19(-319.65,-531.5) BA20(-280.28,-531.5) BA21(-240.91,-531.5) BA22(-201.53,-531.5) BA23(-162.16,-531.5) BA24(-122.8,-531.5) BA25(-83.42,-531.5) BA26(-44.05,-531.5) BA27(-4.68,-531.5) BA28(34.69,-531.5) BA29(74.06,-531.5) BA30(113.42,-531.5) BA31(152.79,-531.5) BA32(192.16,-531.5) BA33(231.53,-531.5) BA34(270.91,-531.5) BA35(310.28,-531.5) BA36(349.65,-531.5) BA37(389.02,-531.5) BA38(428.39,-531.5) BA39(467.76,-531.5) BA40(507.13,-531.5) BA41(546.5,-531.5) BA42(585.87,-531.5) BA43(625.24,-531.5) BA44(664.61,-531.5) BA45(703.98,-531.5) BA46(743.35,-531.5) BA47(782.72,-531.5) BA48(822.09,-531.5) BA49(861.46,-531.5) BA50(900.83,-531.5) BA51(940.2,-531.5) BA52(979.57,-531.5) BA53(1018.94,-531.5) BA54(1058.31,-531.5) BB1(-1028.31,-570.87) BB2(-988.94,-570.87) BB3(-949.57,-570.87) BB4(-910.2,-570.87) BB5(-870.83,-570.87) BB6(-831.46,-570.87) BB7(-792.09,-570.87) BB8(-752.72,-570.87) BB9(-713.35,-570.87) BB10(-673.98,-570.87) BB11(-634.61,-570.87) BB12(-595.24,-570.87) BB13(-555.87,-570.87) BB14(-516.5,-570.87) BB15(-477.13,-570.87) BB16(-437.76,-570.87) BB17(-398.39,-570.87) BB18(-359.02,-570.87) BB19(-319.65,-570.87) BB20(-280.28,-570.87) BB21(-240.91,-570.87) BB22(-201.53,-570.87) BB23(-162.16,-570.87) BB24(-122.8,-570.87) BB25(-83.42,-570.87) BB26(-44.05,-570.87) BB27(-4.68,-570.87) BB28(34.69,-570.87) BB29(74.06,-570.87) BB30(113.42,-570.87) BB31(152.79,-570.87) BB32(192.16,-570.87) BB33(231.53,-570.87) BB34(270.91,-570.87) BB35(310.28,-570.87) BB36(349.65,-570.87) BB37(389.02,-570.87) BB38(428.39,-570.87) BB39(467.76,-570.87) BB40(507.13,-570.87) BB41(546.5,-570.87) BB42(585.87,-570.87) BB43(625.24,-570.87) BB44(664.61,-570.87) BB45(703.98,-570.87) BB46(743.35,-570.87) BB47(782.72,-570.87) BB48(822.09,-570.87) BB49(861.46,-570.87) BB50(900.83,-570.87) BB51(940.2,-570.87) BB52(979.57,-570.87) BB53(1018.94,-570.87) BB54(1058.31,-570.87) BC1(-1028.31,-610.24) BC2(-988.94,-610.24) BC3(-949.57,-610.24) BC4(-910.2,-610.24) BC5(-870.83,-610.24) BC6(-831.46,-610.24) BC7(-792.09,-610.24) BC8(-752.72,-610.24) BC9(-713.35,-610.24) BC10(-673.98,-610.24) BC11(-634.61,-610.24) BC12(-595.24,-610.24) BC13(-555.87,-610.24) BC14(-516.5,-610.24) BC15(-477.13,-610.24) BC16(-437.76,-610.24) BC17(-398.39,-610.24) BC18(-359.02,-610.24) BC19(-319.65,-610.24) BC20(-280.28,-610.24) BC21(-240.91,-610.24) BC22(-201.53,-610.24) BC23(-162.16,-610.24) BC24(-122.8,-610.24) BC25(-83.42,-610.24) BC26(-44.05,-610.24) BC27(-4.68,-610.24) BC28(34.69,-610.24) BC29(74.06,-610.24) BC30(113.42,-610.24) BC31(152.79,-610.24) BC32(192.16,-610.24) BC33(231.53,-610.24) BC34(270.91,-610.24) BC35(310.28,-610.24) BC36(349.65,-610.24) BC37(389.02,-610.24) BC38(428.39,-610.24) BC39(467.76,-610.24) BC40(507.13,-610.24) BC41(546.5,-610.24) BC42(585.87,-610.24) BC43(625.24,-610.24) BC44(664.61,-610.24) BC45(703.98,-610.24) BC46(743.35,-610.24) BC47(782.72,-610.24) BC48(822.09,-610.24) BC49(861.46,-610.24) BC50(900.83,-610.24) BC51(940.2,-610.24) BC52(979.57,-610.24) BC53(1018.94,-610.24) BC54(1058.31,-610.24) BD1(-1028.31,-649.61) BD2(-988.94,-649.61) BD3(-949.57,-649.61) BD4(-910.2,-649.61) BD5(-870.83,-649.61) BD6(-831.46,-649.61) BD7(-792.09,-649.61) BD8(-752.72,-649.61) BD9(-713.35,-649.61) BD10(-673.98,-649.61) BD11(-634.61,-649.61) BD12(-595.24,-649.61) BD13(-555.87,-649.61) BD14(-516.5,-649.61) BD15(-477.13,-649.61) BD16(-437.76,-649.61) BD17(-398.39,-649.61) BD18(-359.02,-649.61) BD19(-319.65,-649.61) BD20(-280.28,-649.61) BD21(-240.91,-649.61) BD22(-201.53,-649.61) BD23(-162.16,-649.61) BD24(-122.8,-649.61) BD25(-83.42,-649.61) BD26(-44.05,-649.61) BD27(-4.68,-649.61) BD28(34.69,-649.61) BD29(74.06,-649.61) BD30(113.42,-649.61) BD31(152.79,-649.61) BD32(192.16,-649.61) BD33(231.53,-649.61) BD34(270.91,-649.61) BD35(310.28,-649.61) BD36(349.65,-649.61) BD37(389.02,-649.61) BD38(428.39,-649.61) BD39(467.76,-649.61) BD40(507.13,-649.61) BD41(546.5,-649.61) BD42(585.87,-649.61) BD43(625.24,-649.61) BD44(664.61,-649.61) BD45(703.98,-649.61) BD46(743.35,-649.61) BD47(782.72,-649.61) BD48(822.09,-649.61) BD49(861.46,-649.61) BD50(900.83,-649.61) BD51(940.2,-649.61) BD52(979.57,-649.61) BD53(1018.94,-649.61) BD54(1058.31,-649.61) BE1(-1028.31,-688.98) BE2(-988.94,-688.98) BE3(-949.57,-688.98) BE4(-910.2,-688.98) BE5(-870.83,-688.98) BE6(-831.46,-688.98) BE7(-792.09,-688.98) BE8(-752.72,-688.98) BE9(-713.35,-688.98) BE10(-673.98,-688.98) BE11(-634.61,-688.98) BE12(-595.24,-688.98) BE13(-555.87,-688.98) BE14(-516.5,-688.98) BE15(-477.13,-688.98) BE16(-437.76,-688.98) BE17(-398.39,-688.98) BE18(-359.02,-688.98) BE19(-319.65,-688.98) BE20(-280.28,-688.98) BE21(-240.91,-688.98) BE22(-201.53,-688.98) BE23(-162.16,-688.98) BE24(-122.8,-688.98) BE25(-83.42,-688.98) BE26(-44.05,-688.98) BE27(-4.68,-688.98) BE28(34.69,-688.98) BE29(74.06,-688.98) BE30(113.42,-688.98) BE31(152.79,-688.98) BE32(192.16,-688.98) BE33(231.53,-688.98) BE34(270.91,-688.98) BE35(310.28,-688.98) BE36(349.65,-688.98) BE37(389.02,-688.98) BE38(428.39,-688.98) BE39(467.76,-688.98) BE40(507.13,-688.98) BE41(546.5,-688.98) BE42(585.87,-688.98) BE43(625.24,-688.98) BE44(664.61,-688.98) BE45(703.98,-688.98) BE46(743.35,-688.98) BE47(782.72,-688.98) BE48(822.09,-688.98) BE49(861.46,-688.98) BE50(900.83,-688.98) BE51(940.2,-688.98) BE52(979.57,-688.98) BE53(1018.94,-688.98) BE54(1058.31,-688.98) BF1(-1028.31,-728.35) BF2(-988.94,-728.35) BF3(-949.57,-728.35) BF4(-910.2,-728.35) BF5(-870.83,-728.35) BF6(-831.46,-728.35) BF7(-792.09,-728.35) BF8(-752.72,-728.35) BF9(-713.35,-728.35) BF10(-673.98,-728.35) BF11(-634.61,-728.35) BF12(-595.24,-728.35) BF13(-555.87,-728.35) BF14(-516.5,-728.35) BF15(-477.13,-728.35) BF16(-437.76,-728.35) BF17(-398.39,-728.35) BF18(-359.02,-728.35) BF19(-319.65,-728.35) BF20(-280.28,-728.35) BF21(-240.91,-728.35) BF22(-201.53,-728.35) BF23(-162.16,-728.35) BF24(-122.8,-728.35) BF25(-83.42,-728.35) BF26(-44.05,-728.35) BF27(-4.68,-728.35) BF28(34.69,-728.35) BF29(74.06,-728.35) BF30(113.42,-728.35) BF31(152.79,-728.35) BF32(192.16,-728.35) BF33(231.53,-728.35) BF34(270.91,-728.35) BF35(310.28,-728.35) BF36(349.65,-728.35) BF37(389.02,-728.35) BF38(428.39,-728.35) BF39(467.76,-728.35) BF40(507.13,-728.35) BF41(546.5,-728.35) BF42(585.87,-728.35) BF43(625.24,-728.35) BF44(664.61,-728.35) BF45(703.98,-728.35) BF46(743.35,-728.35) BF47(782.72,-728.35) BF48(822.09,-728.35) BF49(861.46,-728.35) BF50(900.83,-728.35) BF51(940.2,-728.35) BF52(979.57,-728.35) BF53(1018.94,-728.35) BF54(1058.31,-728.35) BG1(-1028.31,-767.72) BG2(-988.94,-767.72) BG3(-949.57,-767.72) BG4(-910.2,-767.72) BG5(-870.83,-767.72) BG6(-831.46,-767.72) BG7(-792.09,-767.72) BG8(-752.72,-767.72) BG9(-713.35,-767.72) BG10(-673.98,-767.72) BG11(-634.61,-767.72) BG12(-595.24,-767.72) BG13(-555.87,-767.72) BG14(-516.5,-767.72) BG15(-477.13,-767.72) BG16(-437.76,-767.72) BG17(-398.39,-767.72) BG18(-359.02,-767.72) BG19(-319.65,-767.72) BG20(-280.28,-767.72) BG21(-240.91,-767.72) BG22(-201.53,-767.72) BG23(-162.16,-767.72) BG24(-122.8,-767.72) BG25(-83.42,-767.72) BG26(-44.05,-767.72) BG27(-4.68,-767.72) BG28(34.69,-767.72) BG29(74.06,-767.72) BG30(113.42,-767.72) BG31(152.79,-767.72) BG32(192.16,-767.72) BG33(231.53,-767.72) BG34(270.91,-767.72) BG35(310.28,-767.72) BG36(349.65,-767.72) BG37(389.02,-767.72) BG38(428.39,-767.72) BG39(467.76,-767.72) BG40(507.13,-767.72) BG41(546.5,-767.72) BG42(585.87,-767.72) BG43(625.24,-767.72) BG44(664.61,-767.72) BG45(703.98,-767.72) BG46(743.35,-767.72) BG47(782.72,-767.72) BG48(822.09,-767.72) BG49(861.46,-767.72) BG50(900.83,-767.72) BG51(940.2,-767.72) BG52(979.57,-767.72) BG53(1018.94,-767.72) BG54(1058.31,-767.72) BH1(-1028.31,-807.09) BH2(-988.94,-807.09) BH3(-949.57,-807.09) BH4(-910.2,-807.09) BH5(-870.83,-807.09) BH6(-831.46,-807.09) BH7(-792.09,-807.09) BH8(-752.72,-807.09) BH9(-713.35,-807.09) BH10(-673.98,-807.09) BH11(-634.61,-807.09) BH12(-595.24,-807.09) BH13(-555.87,-807.09) BH14(-516.5,-807.09) BH15(-477.13,-807.09) BH16(-437.76,-807.09) BH17(-398.39,-807.09) BH18(-359.02,-807.09) BH19(-319.65,-807.09) BH20(-280.28,-807.09) BH21(-240.91,-807.09) BH22(-201.53,-807.09) BH23(-162.16,-807.09) BH24(-122.8,-807.09) BH25(-83.42,-807.09) BH26(-44.05,-807.09) BH27(-4.68,-807.09) BH28(34.69,-807.09) BH29(74.06,-807.09) BH30(113.42,-807.09) BH31(152.79,-807.09) BH32(192.16,-807.09) BH33(231.53,-807.09) BH34(270.91,-807.09) BH35(310.28,-807.09) BH36(349.65,-807.09) BH37(389.02,-807.09) BH38(428.39,-807.09) BH39(467.76,-807.09) BH40(507.13,-807.09) BH41(546.5,-807.09) BH42(585.87,-807.09) BH43(625.24,-807.09) BH44(664.61,-807.09) BH45(703.98,-807.09) BH46(743.35,-807.09) BH47(782.72,-807.09) BH48(822.09,-807.09) BH49(861.46,-807.09) BH50(900.83,-807.09) BH51(940.2,-807.09) BH52(979.57,-807.09) BH53(1018.94,-807.09) BH54(1058.31,-807.09) BJ1(-1028.31,-846.46) BJ2(-988.94,-846.46) BJ3(-949.57,-846.46) BJ4(-910.2,-846.46) BJ5(-870.83,-846.46) BJ6(-831.46,-846.46) BJ7(-792.09,-846.46) BJ8(-752.72,-846.46) BJ9(-713.35,-846.46) BJ10(-673.98,-846.46) BJ11(-634.61,-846.46) BJ12(-595.24,-846.46) BJ13(-555.87,-846.46) BJ14(-516.5,-846.46) BJ15(-477.13,-846.46) BJ16(-437.76,-846.46) BJ17(-398.39,-846.46) BJ18(-359.02,-846.46) BJ19(-319.65,-846.46) BJ20(-280.28,-846.46) BJ21(-240.91,-846.46) BJ22(-201.53,-846.46) BJ23(-162.16,-846.46) BJ24(-122.8,-846.46) BJ25(-83.42,-846.46) BJ26(-44.05,-846.46) BJ27(-4.68,-846.46) BJ28(34.69,-846.46) BJ29(74.06,-846.46) BJ30(113.42,-846.46) BJ31(152.79,-846.46) BJ32(192.16,-846.46) BJ33(231.53,-846.46) BJ34(270.91,-846.46) BJ35(310.28,-846.46) BJ36(349.65,-846.46) BJ37(389.02,-846.46) BJ38(428.39,-846.46) BJ39(467.76,-846.46) BJ40(507.13,-846.46) BJ41(546.5,-846.46) BJ42(585.87,-846.46) BJ43(625.24,-846.46) BJ44(664.61,-846.46) BJ45(703.98,-846.46) BJ46(743.35,-846.46) BJ47(782.72,-846.46) BJ48(822.09,-846.46) BJ49(861.46,-846.46) BJ50(900.83,-846.46) BJ51(940.2,-846.46) BJ52(979.57,-846.46) BJ53(1018.94,-846.46) BJ54(1058.31,-846.46) BK1(-1028.31,-885.83) BK2(-988.94,-885.83) BK3(-949.57,-885.83) BK4(-910.2,-885.83) BK5(-870.83,-885.83) BK6(-831.46,-885.83) BK7(-792.09,-885.83) BK8(-752.72,-885.83) BK9(-713.35,-885.83) BK10(-673.98,-885.83) BK11(-634.61,-885.83) BK12(-595.24,-885.83) BK13(-555.87,-885.83) BK14(-516.5,-885.83) BK15(-477.13,-885.83) BK16(-437.76,-885.83) BK17(-398.39,-885.83) BK18(-359.02,-885.83) BK19(-319.65,-885.83) BK20(-280.28,-885.83) BK21(-240.91,-885.83) BK22(-201.53,-885.83) BK23(-162.16,-885.83) BK24(-122.8,-885.83) BK25(-83.42,-885.83) BK26(-44.05,-885.83) BK27(-4.68,-885.83) BK28(34.69,-885.83) BK29(74.06,-885.83) BK30(113.42,-885.83) BK31(152.79,-885.83) BK32(192.16,-885.83) BK33(231.53,-885.83) BK34(270.91,-885.83) BK35(310.28,-885.83) BK36(349.65,-885.83) BK37(389.02,-885.83) BK38(428.39,-885.83) BK39(467.76,-885.83) BK40(507.13,-885.83) BK41(546.5,-885.83) BK42(585.87,-885.83) BK43(625.24,-885.83) BK44(664.61,-885.83) BK45(703.98,-885.83) BK46(743.35,-885.83) BK47(782.72,-885.83) BK48(822.09,-885.83) BK49(861.46,-885.83) BK50(900.83,-885.83) BK51(940.2,-885.83) BK52(979.57,-885.83) BK53(1018.94,-885.83) BK54(1058.31,-885.83) BL1(-1028.31,-925.2) BL2(-988.94,-925.2) BL3(-949.57,-925.2) BL4(-910.2,-925.2) BL5(-870.83,-925.2) BL6(-831.46,-925.2) BL7(-792.09,-925.2) BL8(-752.72,-925.2) BL9(-713.35,-925.2) BL10(-673.98,-925.2) BL11(-634.61,-925.2) BL12(-595.24,-925.2) BL13(-555.87,-925.2) BL14(-516.5,-925.2) BL15(-477.13,-925.2) BL16(-437.76,-925.2) BL17(-398.39,-925.2) BL18(-359.02,-925.2) BL19(-319.65,-925.2) BL20(-280.28,-925.2) BL21(-240.91,-925.2) BL22(-201.53,-925.2) BL23(-162.16,-925.2) BL24(-122.8,-925.2) BL25(-83.42,-925.2) BL26(-44.05,-925.2) BL27(-4.68,-925.2) BL28(34.69,-925.2) BL29(74.06,-925.2) BL30(113.42,-925.2) BL31(152.79,-925.2) BL32(192.16,-925.2) BL33(231.53,-925.2) BL34(270.91,-925.2) BL35(310.28,-925.2) BL36(349.65,-925.2) BL37(389.02,-925.2) BL38(428.39,-925.2) BL39(467.76,-925.2) BL40(507.13,-925.2) BL41(546.5,-925.2) BL42(585.87,-925.2) BL43(625.24,-925.2) BL44(664.61,-925.2) BL45(703.98,-925.2) BL46(743.35,-925.2) BL47(782.72,-925.2) BL48(822.09,-925.2) BL49(861.46,-925.2) BL50(900.83,-925.2) BL51(940.2,-925.2) BL52(979.57,-925.2) BL53(1018.94,-925.2) BL54(1058.31,-925.2) BM2(-988.94,-964.57) BM3(-949.57,-964.57) BM4(-910.2,-964.57) BM5(-870.83,-964.57) BM6(-831.46,-964.57) BM7(-792.09,-964.57) BM8(-752.72,-964.57) BM9(-713.35,-964.57) BM10(-673.98,-964.57) BM11(-634.61,-964.57) BM12(-595.24,-964.57) BM13(-555.87,-964.57) BM14(-516.5,-964.57) BM15(-477.13,-964.57) BM16(-437.76,-964.57) BM17(-398.39,-964.57) BM18(-359.02,-964.57) BM19(-319.65,-964.57) BM20(-280.28,-964.57) BM21(-240.91,-964.57) BM22(-201.53,-964.57) BM23(-162.16,-964.57) BM24(-122.8,-964.57) BM25(-83.42,-964.57) BM26(-44.05,-964.57) BM27(-4.68,-964.57) BM28(34.69,-964.57) BM29(74.06,-964.57) BM30(113.42,-964.57) BM31(152.79,-964.57) BM32(192.16,-964.57) BM33(231.53,-964.57) BM34(270.91,-964.57) BM35(310.28,-964.57) BM36(349.65,-964.57) BM37(389.02,-964.57) BM38(428.39,-964.57) BM39(467.76,-964.57) BM40(507.13,-964.57) BM41(546.5,-964.57) BM42(585.87,-964.57) BM43(625.24,-964.57) BM44(664.61,-964.57) BM45(703.98,-964.57) BM46(743.35,-964.57) BM47(782.72,-964.57) BM48(822.09,-964.57) BM49(861.46,-964.57) BM50(900.83,-964.57) BM51(940.2,-964.57) BM52(979.57,-964.57) BM53(1018.94,-964.57) BN3(-949.57,-1003.94) BN4(-910.2,-1003.94) BN5(-870.83,-1003.94) BN6(-831.46,-1003.94) BN7(-792.09,-1003.94) BN8(-752.72,-1003.94) BN9(-713.35,-1003.94) BN10(-673.98,-1003.94) BN11(-634.61,-1003.94) BN12(-595.24,-1003.94) BN13(-555.87,-1003.94) BN14(-516.5,-1003.94) BN15(-477.13,-1003.94) BN16(-437.76,-1003.94) BN17(-398.39,-1003.94) BN18(-359.02,-1003.94) BN19(-319.65,-1003.94) BN20(-280.28,-1003.94) BN21(-240.91,-1003.94) BN22(-201.53,-1003.94) BN23(-162.16,-1003.94) BN24(-122.8,-1003.94) BN25(-83.42,-1003.94) BN26(-44.05,-1003.94) BN27(-4.68,-1003.94) BN28(34.69,-1003.94) BN29(74.06,-1003.94) BN30(113.42,-1003.94) BN31(152.79,-1003.94) BN32(192.16,-1003.94) BN33(231.53,-1003.94) BN34(270.91,-1003.94) BN35(310.28,-1003.94) BN36(349.65,-1003.94) BN37(389.02,-1003.94) BN38(428.39,-1003.94) BN39(467.76,-1003.94) BN40(507.13,-1003.94) BN41(546.5,-1003.94) BN42(585.87,-1003.94) BN43(625.24,-1003.94) BN44(664.61,-1003.94) BN45(703.98,-1003.94) BN46(743.35,-1003.94) BN47(782.72,-1003.94) BN48(822.09,-1003.94) BN49(861.46,-1003.94) BN50(900.83,-1003.94) BN51(940.2,-1003.94) BN52(979.57,-1003.94) BP4(-910.2,-1043.31) BP5(-870.83,-1043.31) BP6(-831.46,-1043.31) BP7(-792.09,-1043.31) BP8(-752.72,-1043.31) BP9(-713.35,-1043.31) BP10(-673.98,-1043.31) BP11(-634.61,-1043.31) BP12(-595.24,-1043.31) BP13(-555.87,-1043.31) BP14(-516.5,-1043.31) BP15(-477.13,-1043.31) BP16(-437.76,-1043.31) BP17(-398.39,-1043.31) BP18(-359.02,-1043.31) BP19(-319.65,-1043.31) BP20(-280.28,-1043.31) BP21(-240.91,-1043.31) BP22(-201.53,-1043.31) BP23(-162.16,-1043.31) BP24(-122.8,-1043.31) BP25(-83.42,-1043.31) BP26(-44.05,-1043.31) BP27(-4.68,-1043.31) BP28(34.69,-1043.31) BP29(74.06,-1043.31) BP30(113.42,-1043.31) BP31(152.79,-1043.31) BP32(192.16,-1043.31) BP33(231.53,-1043.31) BP34(270.91,-1043.31) BP35(310.28,-1043.31) BP36(349.65,-1043.31) BP37(389.02,-1043.31) BP38(428.39,-1043.31) BP39(467.76,-1043.31) BP40(507.13,-1043.31) BP41(546.5,-1043.31) BP42(585.87,-1043.31) BP43(625.24,-1043.31) BP44(664.61,-1043.31) BP45(703.98,-1043.31) BP46(743.35,-1043.31) BP47(782.72,-1043.31) BP48(822.09,-1043.31) BP49(861.46,-1043.31) BP50(900.83,-1043.31) BP51(940.2,-1043.31) C2(-988.94,964.57) C3(-949.57,964.57) C4(-910.2,964.57) C5(-870.83,964.57) C6(-831.46,964.57) C7(-792.09,964.57) C8(-752.72,964.57) C9(-713.35,964.57) C10(-673.98,964.57) C11(-634.61,964.57) C12(-595.24,964.57) C13(-555.87,964.57) C14(-516.5,964.57) C15(-477.13,964.57) C16(-437.76,964.57) C17(-398.39,964.57) C18(-359.02,964.57) C19(-319.65,964.57) C20(-280.28,964.57) C21(-240.91,964.57) C22(-201.53,964.57) C23(-162.16,964.57) C24(-122.8,964.57) C25(-83.42,964.57) C26(-44.05,964.57) C27(-4.68,964.57) C28(34.69,964.57) C29(74.06,964.57) C30(113.42,964.57) C31(152.79,964.57) C32(192.16,964.57) C33(231.53,964.57) C34(270.91,964.57) C35(310.28,964.57) C36(349.65,964.57) C37(389.02,964.57) C38(428.39,964.57) C39(467.76,964.57) C40(507.13,964.57) C41(546.5,964.57) C42(585.87,964.57) C43(625.24,964.57) C44(664.61,964.57) C45(703.98,964.57) C46(743.35,964.57) C47(782.72,964.57) C48(822.09,964.57) C49(861.46,964.57) C50(900.83,964.57) C51(940.2,964.57) C52(979.57,964.57) C53(1018.94,964.57) D1(-1028.31,925.2) D2(-988.94,925.2) D3(-949.57,925.2) D4(-910.2,925.2) D5(-870.83,925.2) D6(-831.46,925.2) D7(-792.09,925.2) D8(-752.72,925.2) D9(-713.35,925.2) D10(-673.98,925.2) D11(-634.61,925.2) D12(-595.24,925.2) D13(-555.87,925.2) D14(-516.5,925.2) D15(-477.13,925.2) D16(-437.76,925.2) D17(-398.39,925.2) D18(-359.02,925.2) D19(-319.65,925.2) D20(-280.28,925.2) D21(-240.91,925.2) D22(-201.53,925.2) D23(-162.16,925.2) D24(-122.8,925.2) D25(-83.42,925.2) D26(-44.05,925.2) D27(-4.68,925.2) D28(34.69,925.2) D29(74.06,925.2) D30(113.42,925.2) D31(152.79,925.2) D32(192.16,925.2) D33(231.53,925.2) D34(270.91,925.2) D35(310.28,925.2) D36(349.65,925.2) D37(389.02,925.2) D38(428.39,925.2) D39(467.76,925.2) D40(507.13,925.2) D41(546.5,925.2) D42(585.87,925.2) D43(625.24,925.2) D44(664.61,925.2) D45(703.98,925.2) D46(743.35,925.2) D47(782.72,925.2) D48(822.09,925.2) D49(861.46,925.2) D50(900.83,925.2) D51(940.2,925.2) D52(979.57,925.2) D53(1018.94,925.2) D54(1058.31,925.2) E1(-1028.31,885.83) E2(-988.94,885.83) E3(-949.57,885.83) E4(-910.2,885.83) E5(-870.83,885.83) E6(-831.46,885.83) E7(-792.09,885.83) E8(-752.72,885.83) E9(-713.35,885.83) E10(-673.98,885.83) E11(-634.61,885.83) E12(-595.24,885.83) E13(-555.87,885.83) E14(-516.5,885.83) E15(-477.13,885.83) E16(-437.76,885.83) E17(-398.39,885.83) E18(-359.02,885.83) E19(-319.65,885.83) E20(-280.28,885.83) E21(-240.91,885.83) E22(-201.53,885.83) E23(-162.16,885.83) E24(-122.8,885.83) E25(-83.42,885.83) E26(-44.05,885.83) E27(-4.68,885.83) E28(34.69,885.83) E29(74.06,885.83) E30(113.42,885.83) E31(152.79,885.83) E32(192.16,885.83) E33(231.53,885.83) E34(270.91,885.83) E35(310.28,885.83) E36(349.65,885.83) E37(389.02,885.83) E38(428.39,885.83) E39(467.76,885.83) E40(507.13,885.83) E41(546.5,885.83) E42(585.87,885.83) E43(625.24,885.83) E44(664.61,885.83) E45(703.98,885.83) E46(743.35,885.83) E47(782.72,885.83) E48(822.09,885.83) E49(861.46,885.83) E50(900.83,885.83) E51(940.2,885.83) E52(979.57,885.83) E53(1018.94,885.83) E54(1058.31,885.83) F1(-1028.31,846.46) F2(-988.94,846.46) F3(-949.57,846.46) F4(-910.2,846.46) F5(-870.83,846.46) F6(-831.46,846.46) F7(-792.09,846.46) F8(-752.72,846.46) F9(-713.35,846.46) F10(-673.98,846.46) F11(-634.61,846.46) F12(-595.24,846.46) F13(-555.87,846.46) F14(-516.5,846.46) F15(-477.13,846.46) F16(-437.76,846.46) F17(-398.39,846.46) F18(-359.02,846.46) F19(-319.65,846.46) F20(-280.28,846.46) F21(-240.91,846.46) F22(-201.53,846.46) F23(-162.16,846.46) F24(-122.8,846.46) F25(-83.42,846.46) F26(-44.05,846.46) F27(-4.68,846.46) F28(34.69,846.46) F29(74.06,846.46) F30(113.42,846.46) F31(152.79,846.46) F32(192.16,846.46) F33(231.53,846.46) F34(270.91,846.46) F35(310.28,846.46) F36(349.65,846.46) F37(389.02,846.46) F38(428.39,846.46) F39(467.76,846.46) F40(507.13,846.46) F41(546.5,846.46) F42(585.87,846.46) F43(625.24,846.46) F44(664.61,846.46) F45(703.98,846.46) F46(743.35,846.46) F47(782.72,846.46) F48(822.09,846.46) F49(861.46,846.46) F50(900.83,846.46) F51(940.2,846.46) F52(979.57,846.46) F53(1018.94,846.46) F54(1058.31,846.46) G1(-1028.31,807.09) G2(-988.94,807.09) G3(-949.57,807.09) G4(-910.2,807.09) G5(-870.83,807.09) G6(-831.46,807.09) G7(-792.09,807.09) G8(-752.72,807.09) G9(-713.35,807.09) G10(-673.98,807.09) G11(-634.61,807.09) G12(-595.24,807.09) G13(-555.87,807.09) G14(-516.5,807.09) G15(-477.13,807.09) G16(-437.76,807.09) G17(-398.39,807.09) G18(-359.02,807.09) G19(-319.65,807.09) G20(-280.28,807.09) G21(-240.91,807.09) G22(-201.53,807.09) G23(-162.16,807.09) G24(-122.8,807.09) G25(-83.42,807.09) G26(-44.05,807.09) G27(-4.68,807.09) G28(34.69,807.09) G29(74.06,807.09) G30(113.42,807.09) G31(152.79,807.09) G32(192.16,807.09) G33(231.53,807.09) G34(270.91,807.09) G35(310.28,807.09) G36(349.65,807.09) G37(389.02,807.09) G38(428.39,807.09) G39(467.76,807.09) G40(507.13,807.09) G41(546.5,807.09) G42(585.87,807.09) G43(625.24,807.09) G44(664.61,807.09) G45(703.98,807.09) G46(743.35,807.09) G47(782.72,807.09) G48(822.09,807.09) G49(861.46,807.09) G50(900.83,807.09) G51(940.2,807.09) G52(979.57,807.09) G53(1018.94,807.09) G54(1058.31,807.09) H1(-1028.31,767.72) H2(-988.94,767.72) H3(-949.57,767.72) H4(-910.2,767.72) H5(-870.83,767.72) H6(-831.46,767.72) H7(-792.09,767.72) H8(-752.72,767.72) H9(-713.35,767.72) H10(-673.98,767.72) H11(-634.61,767.72) H12(-595.24,767.72) H13(-555.87,767.72) H14(-516.5,767.72) H15(-477.13,767.72) H16(-437.76,767.72) H17(-398.39,767.72) H18(-359.02,767.72) H19(-319.65,767.72) H20(-280.28,767.72) H21(-240.91,767.72) H22(-201.53,767.72) H23(-162.16,767.72) H24(-122.8,767.72) H25(-83.42,767.72) H26(-44.05,767.72) H27(-4.68,767.72) H28(34.69,767.72) H29(74.06,767.72) H30(113.42,767.72) H31(152.79,767.72) H32(192.16,767.72) H33(231.53,767.72) H34(270.91,767.72) H35(310.28,767.72) H36(349.65,767.72) H37(389.02,767.72) H38(428.39,767.72) H39(467.76,767.72) H40(507.13,767.72) H41(546.5,767.72) H42(585.87,767.72) H43(625.24,767.72) H44(664.61,767.72) H45(703.98,767.72) H46(743.35,767.72) H47(782.72,767.72) H48(822.09,767.72) H49(861.46,767.72) H50(900.83,767.72) H51(940.2,767.72) H52(979.57,767.72) H53(1018.94,767.72) H54(1058.31,767.72) J1(-1028.31,728.35) J2(-988.94,728.35) J3(-949.57,728.35) J4(-910.2,728.35) J5(-870.83,728.35) J6(-831.46,728.35) J7(-792.09,728.35) J8(-752.72,728.35) J9(-713.35,728.35) J10(-673.98,728.35) J11(-634.61,728.35) J12(-595.24,728.35) J13(-555.87,728.35) J14(-516.5,728.35) J15(-477.13,728.35) J16(-437.76,728.35) J17(-398.39,728.35) J18(-359.02,728.35) J19(-319.65,728.35) J20(-280.28,728.35) J21(-240.91,728.35) J22(-201.53,728.35) J23(-162.16,728.35) J24(-122.8,728.35) J25(-83.42,728.35) J26(-44.05,728.35) J27(-4.68,728.35) J28(34.69,728.35) J29(74.06,728.35) J30(113.42,728.35) J31(152.79,728.35) J32(192.16,728.35) J33(231.53,728.35) J34(270.91,728.35) J35(310.28,728.35) J36(349.65,728.35) J37(389.02,728.35) J38(428.39,728.35) J39(467.76,728.35) J40(507.13,728.35) J41(546.5,728.35) J42(585.87,728.35) J43(625.24,728.35) J44(664.61,728.35) J45(703.98,728.35) J46(743.35,728.35) J47(782.72,728.35) J48(822.09,728.35) J49(861.46,728.35) J50(900.83,728.35) J51(940.2,728.35) J52(979.57,728.35) J53(1018.94,728.35) J54(1058.31,728.35) K1(-1028.31,688.98) K2(-988.94,688.98) K3(-949.57,688.98) K4(-910.2,688.98) K5(-870.83,688.98) K6(-831.46,688.98) K7(-792.09,688.98) K8(-752.72,688.98) K9(-713.35,688.98) K10(-673.98,688.98) K11(-634.61,688.98) K12(-595.24,688.98) K13(-555.87,688.98) K14(-516.5,688.98) K15(-477.13,688.98) K16(-437.76,688.98) K17(-398.39,688.98) K18(-359.02,688.98) K19(-319.65,688.98) K20(-280.28,688.98) K21(-240.91,688.98) K22(-201.53,688.98) K23(-162.16,688.98) K24(-122.8,688.98) K25(-83.42,688.98) K26(-44.05,688.98) K27(-4.68,688.98) K28(34.69,688.98) K29(74.06,688.98) K30(113.42,688.98) K31(152.79,688.98) K32(192.16,688.98) K33(231.53,688.98) K34(270.91,688.98) K35(310.28,688.98) K36(349.65,688.98) K37(389.02,688.98) K38(428.39,688.98) K39(467.76,688.98) K40(507.13,688.98) K41(546.5,688.98) K42(585.87,688.98) K43(625.24,688.98) K44(664.61,688.98) K45(703.98,688.98) K46(743.35,688.98) K47(782.72,688.98) K48(822.09,688.98) K49(861.46,688.98) K50(900.83,688.98) K51(940.2,688.98) K52(979.57,688.98) K53(1018.94,688.98) K54(1058.31,688.98) L1(-1028.31,649.61) L2(-988.94,649.61) L3(-949.57,649.61) L4(-910.2,649.61) L5(-870.83,649.61) L6(-831.46,649.61) L7(-792.09,649.61) L8(-752.72,649.61) L9(-713.35,649.61) L10(-673.98,649.61) L11(-634.61,649.61) L12(-595.24,649.61) L13(-555.87,649.61) L14(-516.5,649.61) L15(-477.13,649.61) L16(-437.76,649.61) L17(-398.39,649.61) L18(-359.02,649.61) L19(-319.65,649.61) L20(-280.28,649.61) L21(-240.91,649.61) L22(-201.53,649.61) L23(-162.16,649.61) L24(-122.8,649.61) L25(-83.42,649.61) L26(-44.05,649.61) L27(-4.68,649.61) L28(34.69,649.61) L29(74.06,649.61) L30(113.42,649.61) L31(152.79,649.61) L32(192.16,649.61) L33(231.53,649.61) L34(270.91,649.61) L35(310.28,649.61) L36(349.65,649.61) L37(389.02,649.61) L38(428.39,649.61) L39(467.76,649.61) L40(507.13,649.61) L41(546.5,649.61) L42(585.87,649.61) L43(625.24,649.61) L44(664.61,649.61) L45(703.98,649.61) L46(743.35,649.61) L47(782.72,649.61) L48(822.09,649.61) L49(861.46,649.61) L50(900.83,649.61) L51(940.2,649.61) L52(979.57,649.61) L53(1018.94,649.61) L54(1058.31,649.61) M1(-1028.31,610.24) M2(-988.94,610.24) M3(-949.57,610.24) M4(-910.2,610.24) M5(-870.83,610.24) M6(-831.46,610.24) M7(-792.09,610.24) M8(-752.72,610.24) M9(-713.35,610.24) M10(-673.98,610.24) M11(-634.61,610.24) M12(-595.24,610.24) M13(-555.87,610.24) M14(-516.5,610.24) M15(-477.13,610.24) M16(-437.76,610.24) M17(-398.39,610.24) M18(-359.02,610.24) M19(-319.65,610.24) M20(-280.28,610.24) M21(-240.91,610.24) M22(-201.53,610.24) M23(-162.16,610.24) M24(-122.8,610.24) M25(-83.42,610.24) M26(-44.05,610.24) M27(-4.68,610.24) M28(34.69,610.24) M29(74.06,610.24) M30(113.42,610.24) M31(152.79,610.24) M32(192.16,610.24) M33(231.53,610.24) M34(270.91,610.24) M35(310.28,610.24) M36(349.65,610.24) M37(389.02,610.24) M38(428.39,610.24) M39(467.76,610.24) M40(507.13,610.24) M41(546.5,610.24) M42(585.87,610.24) M43(625.24,610.24) M44(664.61,610.24) M45(703.98,610.24) M46(743.35,610.24) M47(782.72,610.24) M48(822.09,610.24) M49(861.46,610.24) M50(900.83,610.24) M51(940.2,610.24) M52(979.57,610.24) M53(1018.94,610.24) M54(1058.31,610.24) N1(-1028.31,570.87) N2(-988.94,570.87) N3(-949.57,570.87) N4(-910.2,570.87) N5(-870.83,570.87) N6(-831.46,570.87) N7(-792.09,570.87) N8(-752.72,570.87) N9(-713.35,570.87) N10(-673.98,570.87) N11(-634.61,570.87) N12(-595.24,570.87) N13(-555.87,570.87) N14(-516.5,570.87) N15(-477.13,570.87) N16(-437.76,570.87) N17(-398.39,570.87) N18(-359.02,570.87) N19(-319.65,570.87) N20(-280.28,570.87) N21(-240.91,570.87) N22(-201.53,570.87) N23(-162.16,570.87) N24(-122.8,570.87) N25(-83.42,570.87) N26(-44.05,570.87) N27(-4.68,570.87) N28(34.69,570.87) N29(74.06,570.87) N30(113.42,570.87) N31(152.79,570.87) N32(192.16,570.87) N33(231.53,570.87) N34(270.91,570.87) N35(310.28,570.87) N36(349.65,570.87) N37(389.02,570.87) N38(428.39,570.87) N39(467.76,570.87) N40(507.13,570.87) N41(546.5,570.87) N42(585.87,570.87) N43(625.24,570.87) N44(664.61,570.87) N45(703.98,570.87) N46(743.35,570.87) N47(782.72,570.87) N48(822.09,570.87) N49(861.46,570.87) N50(900.83,570.87) N51(940.2,570.87) N52(979.57,570.87) N53(1018.94,570.87) N54(1058.31,570.87) P1(-1028.31,531.5) P2(-988.94,531.5) P3(-949.57,531.5) P4(-910.2,531.5) P5(-870.83,531.5) P6(-831.46,531.5) P7(-792.09,531.5) P8(-752.72,531.5) P9(-713.35,531.5) P10(-673.98,531.5) P11(-634.61,531.5) P12(-595.24,531.5) P13(-555.87,531.5) P14(-516.5,531.5) P15(-477.13,531.5) P16(-437.76,531.5) P17(-398.39,531.5) P18(-359.02,531.5) P19(-319.65,531.5) P20(-280.28,531.5) P21(-240.91,531.5) P22(-201.53,531.5) P23(-162.16,531.5) P24(-122.8,531.5) P25(-83.42,531.5) P26(-44.05,531.5) P27(-4.68,531.5) P28(34.69,531.5) P29(74.06,531.5) P30(113.42,531.5) P31(152.79,531.5) P32(192.16,531.5) P33(231.53,531.5) P34(270.91,531.5) P35(310.28,531.5) P36(349.65,531.5) P37(389.02,531.5) P38(428.39,531.5) P39(467.76,531.5) P40(507.13,531.5) P41(546.5,531.5) P42(585.87,531.5) P43(625.24,531.5) P44(664.61,531.5) P45(703.98,531.5) P46(743.35,531.5) P47(782.72,531.5) P48(822.09,531.5) P49(861.46,531.5) P50(900.83,531.5) P51(940.2,531.5) P52(979.57,531.5) P53(1018.94,531.5) P54(1058.31,531.5) R1(-1028.31,492.13) R2(-988.94,492.13) R3(-949.57,492.13) R4(-910.2,492.13) R5(-870.83,492.13) R6(-831.46,492.13) R7(-792.09,492.13) R8(-752.72,492.13) R9(-713.35,492.13) R10(-673.98,492.13) R11(-634.61,492.13) R12(-595.24,492.13) R13(-555.87,492.13) R14(-516.5,492.13) R15(-477.13,492.13) R16(-437.76,492.13) R17(-398.39,492.13) R18(-359.02,492.13) R19(-319.65,492.13) R20(-280.28,492.13) R21(-240.91,492.13) R22(-201.53,492.13) R23(-162.16,492.13) R24(-122.8,492.13) R25(-83.42,492.13) R26(-44.05,492.13) R27(-4.68,492.13) R28(34.69,492.13) R29(74.06,492.13) R30(113.42,492.13) R31(152.79,492.13) R32(192.16,492.13) R33(231.53,492.13) R34(270.91,492.13) R35(310.28,492.13) R36(349.65,492.13) R37(389.02,492.13) R38(428.39,492.13) R39(467.76,492.13) R40(507.13,492.13) R41(546.5,492.13) R42(585.87,492.13) R43(625.24,492.13) R44(664.61,492.13) R45(703.98,492.13) R46(743.35,492.13) R47(782.72,492.13) R48(822.09,492.13) R49(861.46,492.13) R50(900.83,492.13) R51(940.2,492.13) R52(979.57,492.13) R53(1018.94,492.13) R54(1058.31,492.13) T1(-1028.31,452.76) T2(-988.94,452.76) T3(-949.57,452.76) T4(-910.2,452.76) T5(-870.83,452.76) T6(-831.46,452.76) T7(-792.09,452.76) T8(-752.72,452.76) T9(-713.35,452.76) T10(-673.98,452.76) T11(-634.61,452.76) T12(-595.24,452.76) T13(-555.87,452.76) T14(-516.5,452.76) T15(-477.13,452.76) T16(-437.76,452.76) T17(-398.39,452.76) T18(-359.02,452.76) T19(-319.65,452.76) T20(-280.28,452.76) T21(-240.91,452.76) T22(-201.53,452.76) T23(-162.16,452.76) T24(-122.8,452.76) T25(-83.42,452.76) T26(-44.05,452.76) T27(-4.68,452.76) T28(34.69,452.76) T29(74.06,452.76) T30(113.42,452.76) T31(152.79,452.76) T32(192.16,452.76) T33(231.53,452.76) T34(270.91,452.76) T35(310.28,452.76) T36(349.65,452.76) T37(389.02,452.76) T38(428.39,452.76) T39(467.76,452.76) T40(507.13,452.76) T41(546.5,452.76) T42(585.87,452.76) T43(625.24,452.76) T44(664.61,452.76) T45(703.98,452.76) T46(743.35,452.76) T47(782.72,452.76) T48(822.09,452.76) T49(861.46,452.76) T50(900.83,452.76) T51(940.2,452.76) T52(979.57,452.76) T53(1018.94,452.76) T54(1058.31,452.76) U1(-1028.31,413.39) U2(-988.94,413.39) U3(-949.57,413.39) U4(-910.2,413.39) U5(-870.83,413.39) U6(-831.46,413.39) U7(-792.09,413.39) U8(-752.72,413.39) U9(-713.35,413.39) U10(-673.98,413.39) U11(-634.61,413.39) U12(-595.24,413.39) U13(-555.87,413.39) U14(-516.5,413.39) U15(-477.13,413.39) U16(-437.76,413.39) U17(-398.39,413.39) U18(-359.02,413.39) U19(-319.65,413.39) U20(-280.28,413.39) U21(-240.91,413.39) U22(-201.53,413.39) U23(-162.16,413.39) U24(-122.8,413.39) U25(-83.42,413.39) U26(-44.05,413.39) U27(-4.68,413.39) U28(34.69,413.39) U29(74.06,413.39) U30(113.42,413.39) U31(152.79,413.39) U32(192.16,413.39) U33(231.53,413.39) U34(270.91,413.39) U35(310.28,413.39) U36(349.65,413.39) U37(389.02,413.39) U38(428.39,413.39) U39(467.76,413.39) U40(507.13,413.39) U41(546.5,413.39) U42(585.87,413.39) U43(625.24,413.39) U44(664.61,413.39) U45(703.98,413.39) U46(743.35,413.39) U47(782.72,413.39) U48(822.09,413.39) U49(861.46,413.39) U50(900.83,413.39) U51(940.2,413.39) U52(979.57,413.39) U53(1018.94,413.39) U54(1058.31,413.39) V1(-1028.31,374.02) V2(-988.94,374.02) V3(-949.57,374.02) V4(-910.2,374.02) V5(-870.83,374.02) V6(-831.46,374.02) V7(-792.09,374.02) V8(-752.72,374.02) V9(-713.35,374.02) V10(-673.98,374.02) V11(-634.61,374.02) V12(-595.24,374.02) V13(-555.87,374.02) V14(-516.5,374.02) V15(-477.13,374.02) V16(-437.76,374.02) V17(-398.39,374.02) V18(-359.02,374.02) V19(-319.65,374.02) V20(-280.28,374.02) V21(-240.91,374.02) V22(-201.53,374.02) V23(-162.16,374.02) V24(-122.8,374.02) V25(-83.42,374.02) V26(-44.05,374.02) V27(-4.68,374.02) V28(34.69,374.02) V29(74.06,374.02) V30(113.42,374.02) V31(152.79,374.02) V32(192.16,374.02) V33(231.53,374.02) V34(270.91,374.02) V35(310.28,374.02) V36(349.65,374.02) V37(389.02,374.02) V38(428.39,374.02) V39(467.76,374.02) V40(507.13,374.02) V41(546.5,374.02) V42(585.87,374.02) V43(625.24,374.02) V44(664.61,374.02) V45(703.98,374.02) V46(743.35,374.02) V47(782.72,374.02) V48(822.09,374.02) V49(861.46,374.02) V50(900.83,374.02) V51(940.2,374.02) V52(979.57,374.02) V53(1018.94,374.02) V54(1058.31,374.02) W1(-1028.31,334.65) W2(-988.94,334.65) W3(-949.57,334.65) W4(-910.2,334.65) W5(-870.83,334.65) W6(-831.46,334.65) W7(-792.09,334.65) W8(-752.72,334.65) W9(-713.35,334.65) W10(-673.98,334.65) W11(-634.61,334.65) W12(-595.24,334.65) W13(-555.87,334.65) W14(-516.5,334.65) W15(-477.13,334.65) W16(-437.76,334.65) W17(-398.39,334.65) W18(-359.02,334.65) W19(-319.65,334.65) W20(-280.28,334.65) W21(-240.91,334.65) W22(-201.53,334.65) W23(-162.16,334.65) W24(-122.8,334.65) W25(-83.42,334.65) W26(-44.05,334.65) W27(-4.68,334.65) W28(34.69,334.65) W29(74.06,334.65) W30(113.42,334.65) W31(152.79,334.65) W32(192.16,334.65) W33(231.53,334.65) W34(270.91,334.65) W35(310.28,334.65) W36(349.65,334.65) W37(389.02,334.65) W38(428.39,334.65) W39(467.76,334.65) W40(507.13,334.65) W41(546.5,334.65) W42(585.87,334.65) W43(625.24,334.65) W44(664.61,334.65) W45(703.98,334.65) W46(743.35,334.65) W47(782.72,334.65) W48(822.09,334.65) W49(861.46,334.65) W50(900.83,334.65) W51(940.2,334.65) W52(979.57,334.65) W53(1018.94,334.65) W54(1058.31,334.65) Y1(-1028.31,295.28) Y2(-988.94,295.28) Y3(-949.57,295.28) Y4(-910.2,295.28) Y5(-870.83,295.28) Y6(-831.46,295.28) Y7(-792.09,295.28) Y8(-752.72,295.28) Y9(-713.35,295.28) Y10(-673.98,295.28) Y11(-634.61,295.28) Y12(-595.24,295.28) Y13(-555.87,295.28) Y14(-516.5,295.28) Y15(-477.13,295.28) Y16(-437.76,295.28) Y17(-398.39,295.28) Y18(-359.02,295.28) Y19(-319.65,295.28) Y20(-280.28,295.28) Y21(-240.91,295.28) Y22(-201.53,295.28) Y23(-162.16,295.28) Y24(-122.8,295.28) Y25(-83.42,295.28) Y26(-44.05,295.28) Y27(-4.68,295.28) Y28(34.69,295.28) Y29(74.06,295.28) Y30(113.42,295.28) Y31(152.79,295.28) Y32(192.16,295.28) Y33(231.53,295.28) Y34(270.91,295.28) Y35(310.28,295.28) Y36(349.65,295.28) Y37(389.02,295.28) Y38(428.39,295.28) Y39(467.76,295.28) Y40(507.13,295.28) Y41(546.5,295.28) Y42(585.87,295.28) Y43(625.24,295.28) Y44(664.61,295.28) Y45(703.98,295.28) Y46(743.35,295.28) Y47(782.72,295.28) Y48(822.09,295.28) Y49(861.46,295.28) Y50(900.83,295.28) Y51(940.2,295.28) Y52(979.57,295.28) Y53(1018.94,295.28) Y54(1058.31,295.28) ""(-1028.31,-1043.31) ""(-1028.31,-1003.94) ""(-1028.31,-964.57) ""(-1028.31,964.57) ""(-1028.31,1003.94) ""(-1028.31,1043.31) ""(-988.94,-1043.31) ""(-988.94,-1003.94) ""(-988.94,1003.94) ""(-988.94,1043.31) ""(-949.57,-1043.31) ""(-949.57,1043.31) ""(979.57,-1043.31) ""(979.57,1043.31) ""(1018.94,-1043.31) ""(1018.94,-1003.94) ""(1018.94,1003.94) ""(1018.94,1043.31) ""(1058.31,-1043.31) ""(1058.31,-1003.94) ""(1058.31,-964.57) ""(1058.31,964.57) ""(1058.31,1003.94) ""(1058.31,1043.31)
  round 86 hole 87 unplated: ""(-1180.87,-1181.1) ""(-1180.87,0) ""(-1180.87,1181.1) ""(0.24,-1181.1) ""(0.24,1181.1) ""(1181.34,-1181.1) ""(1181.34,0) ""(1181.34,1181.1)
  round 35 hole 35 unplated: ""(-1180.87,-781.1) ""(1181.34,981.1)
Top Overlay:
  lines w6: -1120,1366.26 -1045,1291.26 -970,1366.26 -970,1441.26 -1120,1441.26 -1120,1366.26
  lines w7.87: -1285,-1285 -1285,1285 1285,1285 1285,-1285 -1285,-1285
  text "PIN" at -1239,1365 h35
  text "A1" at -1172.75,1310.89 h35
Bottom Overlay:
  lines w6: -1045,-885.32 1075,-885.32 ; -1045,-490.31 -709,-490 ; -1045,884.68 1075,884.68 ; -869.68,-1060 -869.68,1060 ; -674.68,1060 -674,700 ; -669,-295 -389,-295 ; -474.69,1060 -474,580 ; 496,100 1075,99.69 ; 505.31,540 505.31,1060 ; 705.32,-1060 705.32,-640 ; 896,295 1075,294.69 ; 900.32,-1060 900.32,1060
  text "A" at -1110.29,1076.63 h35
  text "B" at -1150.29,1046.32 h35
  text "C" at -1110.29,1006.32 h35
  text "D" at -1150.6,966.63 h35
  text "E" at -1110.6,931.63 h35
  text "F" at -1150.6,881.63 h35
  text "G" at -1110.29,846.32 h35
  text "H" at -1150.29,806.32 h35
  text "J" at -1110.29,771.32 h35
  text "K" at -1150.6,726.63 h35
  text "Y" at -1145.6,331.63 h35
  text "W" at -1110.6,371.63 h35
  text "V" at -1145.6,411.63 h35
  text "U" at -1110.6,451.63 h35
  text "T" at -1150.6,486.63 h35
  text "R" at -1110.6,526.63 h35
  text "P" at -1150.6,566.63 h35
  text "N" at -1110.6,606.63 h35
  text "M" at -1150.6,646.63 h35
  text "L" at -1110.6,691.63 h35
  text "AK" at -1128.25,-106.37 h35
  text "AJ" at -1202.94,-67.5 h35
  text "AF" at -1210.25,81.63 h35
  text "AE" at -1150.25,126.63 h35
  text "AD" at -1215.25,166.63 h35
  text "AC" at -1150.25,201.63 h35
  text "AB" at -1215.25,236.63 h35
  text "AA" at -1150.25,271.63 h35
  text "AY" at -1128.25,-496.37 h35
  text "AW" at -1197.94,-452.5 h35
  text "AV" at -1128.25,-416.37 h35
  text "AU" at -1198.25,-371.37 h35
  text "AT" at -1128.25,-336.37 h35
  text "AR" at -1198.25,-291.37 h35
  text "AP" at -1128.25,-266.37 h35
  text "AN" at -1198.25,-221.37 h35
  text "AM" at -1128.25,-186.37 h35
  text "AL" at -1198.25,-146.37 h35
  text "BK" at -1128.25,-896.37 h35
  text "BJ" at -1198.25,-856.37 h35
  text "BH" at -1128.25,-816.37 h35
  text "BG" at -1198.25,-776.37 h35
  text "BF" at -1128.25,-741.37 h35
  text "BE" at -1198.25,-701.37 h35
  text "BD" at -1128.25,-661.37 h35
  text "BC" at -1193.25,-621.37 h35
  text "BB" at -1128.25,-576.37 h35
  text "BA" at -1193.25,-536.37 h35
  text "BL" at -1198.25,-936.37 h35
  text "BM" at -1123.25,-976.37 h35
  text "BN" at -1198.25,-1016.37 h35
  text "BP" at -1119,-1035 h35
  text "1" at -1054,1110 h35
  text "5" at -902.68,1102.68 h35
  text "10" at -714,1155 h35
  text "15" at -512.68,1102.68 h35
  text "20" at -312.69,1102.68 h35
  text "25" at -114.36,1100 h35
  text "30" at 116.69,1097.68 h35
  text "35" at 316.69,1097.68 h35
  text "40" at 516.68,1097.68 h35
  text "45" at 716.68,1097.68 h35
  text "50" at 916.68,1097.68 h35
  text "54" at 1056.68,1097.68 h35
Multi-Layer keep-out:
  region: -1180.87,-815.38 -1171.99,-814.21 -1163.73,-810.79 -1156.63,-805.34 -1151.18,-798.24 -1147.76,-789.97 -1146.59,-781.1 -1147.76,-772.23 -1151.18,-763.96 -1156.63,-756.86 -1163.73,-751.42 -1171.99,-747.99 -1180.87,-746.82 -1189.74,-747.99 -1198.01,-751.42 -1205.1,-756.86 -1210.55,-763.96 -1213.98,-772.23 -1215.14,-781.1 -1213.98,-789.97 -1210.55,-798.24 -1205.1,-805.34 -1198.01,-810.79 -1189.74,-814.21
  region: 1181.34,946.82 1190.21,947.99 1198.48,951.42 1205.58,956.86 1211.02,963.96 1214.45,972.23 1215.62,981.1 1214.45,989.97 1211.02,998.24 1205.58,1005.34 1198.48,1010.79 1190.21,1014.21 1181.34,1015.38 1172.47,1014.21 1164.2,1010.79 1157.1,1005.34 1151.65,998.24 1148.23,989.97 1147.06,981.1 1148.23,972.23 1151.65,963.96 1157.1,956.86 1164.2,951.42 1172.47,947.99
Mechanical55:
  text "AT43" at 625.24,-294.65 h25
  text "AT42" at 585.87,-294.65 h25
  text "AP43" at 625.24,-215.91 h25
  text "AP42" at 585.87,-215.91 h25
  text "AM43" at 625.24,-137.16 h25
  text "AM42" at 585.87,-137.16 h25
  text "AK43" at 625.24,-58.42 h25
  text "AK42" at 585.87,-58.42 h25
  text "AH43" at 625.24,20.32 h25
  text "AH42" at 585.87,20.32 h25
  text "AF43" at 625.24,99.06 h25
  text "AF42" at 585.87,99.06 h25
  text "AD43" at 625.24,177.79 h25
  text "AD42" at 585.87,177.79 h25
  text "AC41" at 546.5,217.16 h25
  text "AC40" at 507.13,217.16 h25
  text "AD47" at 782.72,177.79 h25
  text "AC45" at 703.98,217.16 h25
  text "AB47" at 782.72,256.54 h25
  text "AA49" at 861.46,295.91 h25
  text "AD46" at 743.35,177.79 h25
  text "AC44" at 664.61,217.16 h25
  text "AB46" at 743.35,256.54 h25
  text "AA48" at 822.09,295.91 h25
  text "V43" at 625.24,404.02 h25
  text "V42" at 585.87,404.02 h25
  text "U41" at 546.5,443.39 h25
  text "U40" at 507.13,443.39 h25
  text "P47" at 782.72,561.5 h25
  text "N49" at 861.46,600.87 h25
  text "N45" at 703.98,600.87 h25
  text "M47" at 782.72,640.24 h25
  text "P46" at 743.35,561.5 h25
  text "N48" at 822.09,600.87 h25
  text "N44" at 664.61,600.87 h25
  text "M46" at 743.35,640.24 h25
  text "M43" at 625.24,640.24 h25
  text "M42" at 585.87,640.24 h25
  text "AV12" at -595.24,-373.39 h25
  text "AV13" at -555.87,-373.39 h25
  text "AT12" at -595.24,-294.65 h25
  text "AT13" at -555.87,-294.65 h25
  text "AP12" at -595.24,-215.91 h25
  text "AP13" at -555.87,-215.91 h25
  text "AN14" at -516.5,-176.53 h25
  text "AN15" at -477.13,-176.53 h25
  text "AM12" at -595.24,-137.16 h25
  text "AM13" at -555.87,-137.16 h25
  text "AK12" at -595.24,-58.42 h25
  text "AK13" at -555.87,-58.42 h25
  text "AJ14" at -516.5,-19.05 h25
  text "AJ15" at -477.13,-19.05 h25
  text "AH12" at -595.24,20.32 h25
  text "AH13" at -555.87,20.32 h25
  text "AK8" at -752.72,-68.42 h25
  text "AJ6" at -831.46,-29.05 h25
  text "AJ10" at -673.98,-19.05 h25
  text "AH8" at -752.72,10.31 h25
  text "AK9" at -713.35,-68.42 h25
  text "AJ7" at -792.09,-29.05 h25
  text "AJ11" at -634.61,-19.05 h25
  text "AH9" at -713.35,10.31 h25
  text "AG14" at -516.5,59.69 h25
  text "AG15" at -477.13,59.69 h25
  text "AF12" at -595.24,99.06 h25
  text "AF13" at -555.87,99.06 h25
  text "AG6" at -831.46,49.69 h25
  text "AG10" at -673.98,59.69 h25
  text "AF8" at -752.72,89.06 h25
  text "AE10" at -673.98,138.43 h25
  text "AG7" at -792.09,49.69 h25
  text "AG11" at -634.61,59.69 h25
  text "AF9" at -713.35,89.06 h25
  text "AE11" at -634.61,138.43 h25
  text "AD12" at -595.24,177.79 h25
  text "AD13" at -555.87,177.79 h25
  text "AC14" at -516.5,217.16 h25
  text "AC15" at -477.13,217.16 h25
  text "AD8" at -752.72,167.79 h25
  text "AC10" at -673.98,217.16 h25
  text "AB8" at -752.72,246.53 h25
  text "AA6" at -831.46,285.91 h25
  text "AD9" at -713.35,167.79 h25
  text "AC11" at -634.61,217.16 h25
  text "AB9" at -713.35,246.53 h25
  text "AA7" at -792.09,285.91 h25
  text "AB12" at -595.24,256.54 h25
  text "AB13" at -555.87,256.54 h25
  text "AA14" at -516.5,295.91 h25
  text "AA15" at -477.13,295.91 h25
  text "AA10" at -673.98,295.91 h25
  text "Y8" at -752.72,315.28 h25
  text "W6" at -831.46,354.65 h25
  text "W10" at -673.98,364.65 h25
  text "AA11" at -634.61,295.91 h25
  text "Y9" at -713.35,315.28 h25
  text "W7" at -792.09,354.65 h25
  text "W11" at -634.61,364.65 h25
  text "Y12" at -595.24,325.28 h25
  text "Y13" at -555.87,325.28 h25
  text "W14" at -516.5,364.65 h25
  text "W15" at -477.13,364.65 h25
  text "V8" at -752.72,394.02 h25
  text "U10" at -673.98,443.39 h25
  text "T8" at -752.72,472.76 h25
  text "R10" at -673.98,522.13 h25
  text "V9" at -713.35,394.02 h25
  text "U11" at -634.61,443.39 h25
  text "T9" at -713.35,472.76 h25
  text "R11" at -634.61,522.13 h25
  text "V12" at -595.24,404.02 h25
  text "V13" at -555.87,404.02 h25
  text "U14" at -516.5,443.39 h25
  text "U15" at -477.13,443.39 h25
  text "P8" at -752.72,551.5 h25
  text "N6" at -831.46,590.87 h25
  text "N10" at -673.98,600.87 h25
  text "M8" at -752.72,630.24 h25
  text "P9" at -713.35,551.5 h25
  text "N7" at -792.09,590.87 h25
  text "N11" at -634.61,600.87 h25
  text "M9" at -713.35,630.24 h25
  text "T12" at -595.24,482.76 h25
  text "T13" at -555.87,482.76 h25
  text "R14" at -516.5,522.13 h25
  text "R15" at -477.13,522.13 h25
  text "L6" at -831.46,669.61 h25
  text "L10" at -673.98,679.61 h25
  text "K8" at -752.72,708.98 h25
  text "J6" at -831.46,748.35 h25
  text "L7" at -792.09,669.61 h25
  text "L11" at -634.61,679.61 h25
  text "K9" at -713.35,708.98 h25
  text "J7" at -792.09,748.35 h25
  text "P12" at -595.24,561.5 h25
  text "P13" at -555.87,561.5 h25
  text "M12" at -595.24,640.24 h25
  text "M13" at -555.87,640.24 h25
  text "G6" at -831.46,827.09 h25
  text "E6" at -831.46,905.83 h25
  text "C6" at -831.46,984.57 h25
  text "A5" at -870.83,1063.31 h25
  text "G7" at -792.09,827.09 h25
  text "E7" at -792.09,905.83 h25
  text "C7" at -792.09,984.57 h25
  text "A6" at -831.46,1063.31 h25
  text "BE38" at 428.39,-648.98 h25
  text "BE40" at 507.13,-648.98 h25
  text "BF37" at 389.02,-688.35 h25
  text "BF38" at 428.39,-688.35 h25
  text "BF40" at 507.13,-688.35 h25
  text "BG37" at 389.02,-727.72 h25
  text "BG38" at 428.39,-727.72 h25
  text "BG39" at 467.76,-727.72 h25
  text "BG40" at 507.13,-727.72 h25
  text "BH36" at 349.65,-767.09 h25
  text "BH37" at 389.02,-767.09 h25
  text "BH39" at 467.76,-767.09 h25
  text "BH40" at 507.13,-767.09 h25
  text "BJ36" at 349.65,-806.46 h25
  text "BJ37" at 389.02,-806.46 h25
  text "BJ38" at 428.39,-806.46 h25
  text "BK36" at 349.65,-845.83 h25
  text "BK38" at 428.39,-845.83 h25
  text "BK39" at 467.76,-845.83 h25
  text "BK40" at 507.13,-845.83 h25
  text "BL36" at 349.65,-885.2 h25
  text "BL37" at 389.02,-885.2 h25
  text "BL38" at 428.39,-885.2 h25
  text "BL40" at 507.13,-885.2 h25
  text "BL41" at 546.5,-885.2 h25
  text "BM37" at 389.02,-924.57 h25
  text "BM38" at 428.39,-924.57 h25
  text "BM39" at 467.76,-924.57 h25
  text "BM40" at 507.13,-924.57 h25
  text "BN36" at 349.65,-963.94 h25
  text "BN37" at 389.02,-963.94 h25
  text "BN39" at 467.76,-963.94 h25
  text "BN40" at 507.13,-963.94 h25
  text "BN41" at 546.5,-963.94 h25
  text "BP36" at 349.65,-1003.31 h25
  text "BP37" at 389.02,-1003.31 h25
  text "BP38" at 428.39,-1003.31 h25
  text "BP39" at 467.76,-1003.31 h25
  text "BP41" at 546.5,-1003.31 h25
  text "BF6" at -831.46,-698.35 h25
  text "E16" at -437.76,915.83 h25
  text "F16" at -437.76,876.46 h25
  text "K16" at -437.76,718.98 h25
  text "K17" at -398.39,718.98 h25
  text "L18" at -359.02,679.61 h25
  text "L19" at -319.65,679.61 h25
  text "L20" at -280.28,679.61 h25
  text "L21" at -240.91,679.61 h25
  text "K18" at -359.02,718.98 h25
  text "K19" at -319.65,718.98 h25
  text "J16" at -437.76,758.35 h25
  text "C20" at -280.28,994.57 h25
  text "C19" at -319.65,994.57 h25
  text "L24" at -122.8,679.61 h25
  text "L25" at -83.42,679.61 h25
  text "K26" at -44.05,718.98 h25
  text "L26" at -44.05,679.61 h25
  text "H25" at -83.42,797.72 h25
  text "C27" at -4.68,994.57 h25
  text "C22" at -201.53,994.57 h25
  text "G46" at 743.35,837.09 h25
  text "B43" at 625.24,1033.94 h25
  text "C42" at 585.87,994.57 h25
  text "BE16" at -437.76,-648.98 h25
  text "BE18" at -359.02,-648.98 h25
  text "BF17" at -398.39,-688.35 h25
  text "BF18" at -359.02,-688.35 h25
  text "BF20" at -280.28,-688.35 h25
  text "BG17" at -398.39,-727.72 h25
  text "BG18" at -359.02,-727.72 h25
  text "BG19" at -319.65,-727.72 h25
  text "BG20" at -280.28,-727.72 h25
  text "BH16" at -437.76,-767.09 h25
  text "BH17" at -398.39,-767.09 h25
  text "BH19" at -319.65,-767.09 h25
  text "BH20" at -280.28,-767.09 h25
  text "BJ16" at -437.76,-806.46 h25
  text "BJ17" at -398.39,-806.46 h25
  text "BJ18" at -359.02,-806.46 h25
  text "BK16" at -437.76,-845.83 h25
  text "BK18" at -359.02,-845.83 h25
  text "BK19" at -319.65,-845.83 h25
  text "BK20" at -280.28,-845.83 h25
  text "BL16" at -437.76,-885.2 h25
  text "BL17" at -398.39,-885.2 h25
  text "BL18" at -359.02,-885.2 h25
  text "BL20" at -280.28,-885.2 h25
  text "BL21" at -240.91,-885.2 h25
  text "BM17" at -398.39,-924.57 h25
  text "BM18" at -359.02,-924.57 h25
  text "BM19" at -319.65,-924.57 h25
  text "BM20" at -280.28,-924.57 h25
  text "BN16" at -437.76,-963.94 h25
  text "BN17" at -398.39,-963.94 h25
  text "BN19" at -319.65,-963.94 h25
  text "BN20" at -280.28,-963.94 h25
  text "BN21" at -240.91,-963.94 h25
  text "BP16" at -437.76,-1003.31 h25
  text "BP17" at -398.39,-1003.31 h25
  text "BP18" at -359.02,-1003.31 h25
  text "BP19" at -319.65,-1003.31 h25
  text "BP21" at -240.91,-1003.31 h25
  text "AY41" at 546.5,-452.13 h25
  text "AY42" at 585.87,-452.13 h25
  text "BA41" at 546.5,-491.5 h25
  text "BA42" at 585.87,-491.5 h25
  text "BB41" at 546.5,-530.87 h25
  text "BB42" at 585.87,-530.87 h25
  text "BM29" at 74.06,-924.57 h25
  text "BB14" at -516.5,-530.87 h25
  text "BB15" at -477.13,-530.87 h25
  text "BA15" at -477.13,-491.5 h25
  text "BA13" at -555.87,-491.5 h25
  text "BB13" at -555.87,-530.87 h25
  text "BF15" at -477.13,-688.35 h25
  text "C46" at 743.35,994.57 h25
  text "BF4" at -910.2,-698.35 h25
  text "AM7" at -792.09,-147.16 h25
  text "J5" at -870.83,748.35 h25
  text "J4" at -910.2,748.35 h25
  text "J1" at -1028.31,748.35 h25
  text "J2" at -988.94,748.35 h25
  text "J3" at -949.57,748.35 h25
  text "A4" at -910.2,1063.31 h25
  text "A7" at -792.09,1063.31 h25
  text "A12" at -595.24,1073.31 h25
  text "A17" at -398.39,1073.31 h25
  text "A22" at -201.53,1073.31 h25
  text "A27" at -4.68,1073.31 h25
  text "A32" at 192.16,1073.31 h25
  text "A37" at 389.02,1073.31 h25
  text "A42" at 585.87,1073.31 h25
  text "A47" at 782.72,1073.31 h25
  text "A48" at 822.09,1073.31 h25
  text "A51" at 940.2,1073.31 h25
  text "B3" at -949.57,1023.94 h25
  text "B4" at -910.2,1023.94 h25
  text "B5" at -870.83,1023.94 h25
  text "B6" at -831.46,1023.94 h25
  text "B7" at -792.09,1023.94 h25
  text "B8" at -752.72,1023.94 h25
  text "B9" at -713.35,1023.94 h25
  text "B14" at -516.5,1033.94 h25
  text "B19" at -319.65,1033.94 h25
  text "B24" at -122.8,1033.94 h25
  text "B29" at 74.06,1033.94 h25
  text "B34" at 270.91,1033.94 h25
  text "B39" at 467.76,1033.94 h25
  text "B44" at 664.61,1033.94 h25
  text "B47" at 782.72,1033.94 h25
  text "B48" at 822.09,1033.94 h25
  text "B49" at 861.46,1033.94 h25
  text "B50" at 900.83,1033.94 h25
  text "B51" at 940.2,1033.94 h25
  text "B52" at 979.57,1033.94 h25
  text "C2" at -988.94,984.57 h25
  text "C3" at -949.57,984.57 h25
  text "C4" at -910.2,984.57 h25
  text "C5" at -870.83,984.57 h25
  text "C8" at -752.72,984.57 h25
  text "C11" at -634.61,994.57 h25
  text "C16" at -437.76,994.57 h25
  text "C21" at -240.91,994.57 h25
  text "C26" at -44.05,994.57 h25
  text "C31" at 152.79,994.57 h25
  text "C36" at 349.65,994.57 h25
  text "C41" at 546.5,994.57 h25
  text "C47" at 782.72,994.57 h25
  text "C50" at 900.83,994.57 h25
  text "C51" at 940.2,994.57 h25
  text "C52" at 979.57,994.57 h25
  text "C53" at 1018.94,994.57 h25
  text "D1" at -1028.31,945.2 h25
  text "D2" at -988.94,945.2 h25
  text "D3" at -949.57,945.2 h25
  text "D4" at -910.2,945.2 h25
  text "D5" at -870.83,945.2 h25
  text "D6" at -831.46,945.2 h25
  text "D8" at -752.72,945.2 h25
  text "D13" at -555.87,955.2 h25
  text "D18" at -359.02,955.2 h25
  text "D23" at -162.16,955.2 h25
  text "D28" at 34.69,955.2 h25
  text "D33" at 231.53,955.2 h25
  text "D38" at 428.39,955.2 h25
  text "D43" at 625.24,955.2 h25
  text "D47" at 782.72,955.2 h25
  text "D49" at 861.46,955.2 h25
  text "D50" at 900.83,955.2 h25
  text "D54" at 1058.31,955.2 h25
  text "E1" at -1028.31,905.83 h25
  text "E2" at -988.94,905.83 h25
  text "E3" at -949.57,905.83 h25
  text "E4" at -910.2,905.83 h25
  text "E5" at -870.83,905.83 h25
  text "E8" at -752.72,905.83 h25
  text "E10" at -673.98,915.83 h25
  text "E15" at -477.13,915.83 h25
  text "E20" at -280.28,915.83 h25
  text "E25" at -83.42,915.83 h25
  text "E35" at 310.28,915.83 h25
  text "E45" at 703.98,915.83 h25
  text "E47" at 782.72,915.83 h25
  text "E50" at 900.83,915.83 h25
  text "E51" at 940.2,915.83 h25
  text "E52" at 979.57,915.83 h25
  text "F1" at -1028.31,866.46 h25
  text "F2" at -988.94,866.46 h25
  text "F3" at -949.57,866.46 h25
  text "F4" at -910.2,866.46 h25
  text "F5" at -870.83,866.46 h25
  text "F6" at -831.46,866.46 h25
  text "F8" at -752.72,866.46 h25
  text "F12" at -595.24,876.46 h25
  text "F22" at -201.53,876.46 h25
  text "F32" at 192.16,876.46 h25
  text "F37" at 389.02,876.46 h25
  text "F42" at 585.87,876.46 h25
  text "F47" at 782.72,876.46 h25
  text "F49" at 861.46,876.46 h25
  text "F50" at 900.83,876.46 h25
  text "F53" at 1018.94,876.46 h25
  text "F54" at 1058.31,876.46 h25
  text "G1" at -1028.31,827.09 h25
  text "G2" at -988.94,827.09 h25
  text "G3" at -949.57,827.09 h25
  text "G4" at -910.2,827.09 h25
  text "G5" at -870.83,827.09 h25
  text "G8" at -752.72,827.09 h25
  text "G9" at -713.35,827.09 h25
  text "G19" at -319.65,837.09 h25
  text "G29" at 74.06,837.09 h25
  text "G39" at 467.76,837.09 h25
  text "G47" at 782.72,837.09 h25
  text "G50" at 900.83,837.09 h25
  text "G51" at 940.2,837.09 h25
  text "G52" at 979.57,837.09 h25
  text "H1" at -1028.31,787.72 h25
  text "H2" at -988.94,787.72 h25
  text "H3" at -949.57,787.72 h25
  text "H4" at -910.2,787.72 h25
  text "H5" at -870.83,787.72 h25
  text "H6" at -831.46,787.72 h25
  text "H8" at -752.72,787.72 h25
  text "H16" at -437.76,797.72 h25
  text "H26" at -44.05,797.72 h25
  text "H36" at 349.65,797.72 h25
  text "H46" at 743.35,797.72 h25
  text "H47" at 782.72,797.72 h25
  text "H49" at 861.46,797.72 h25
  text "H50" at 900.83,797.72 h25
  text "H53" at 1018.94,797.72 h25
  text "H54" at 1058.31,797.72 h25
  text "J8" at -752.72,748.35 h25
  text "J9" at -713.35,748.35 h25
  text "J10" at -673.98,758.35 h25
  text "J13" at -555.87,758.35 h25
  text "J23" at -162.16,758.35 h25
  text "J33" at 231.53,758.35 h25
  text "J43" at 625.24,758.35 h25
  text "J45" at 703.98,758.35 h25
  text "J46" at 743.35,758.35 h25
  text "J47" at 782.72,758.35 h25
  text "J50" at 900.83,758.35 h25
  text "J51" at 940.2,758.35 h25
  text "J52" at 979.57,758.35 h25
  text "K1" at -1028.31,708.98 h25
  text "K2" at -988.94,708.98 h25
  text "K3" at -949.57,708.98 h25
  text "K4" at -910.2,708.98 h25
  text "K5" at -870.83,708.98 h25
  text "K6" at -831.46,708.98 h25
  text "K10" at -673.98,718.98 h25
  text "K11" at -634.61,718.98 h25
  text "K12" at -595.24,718.98 h25
  text "K20" at -280.28,718.98 h25
  text "K30" at 113.42,718.98 h25
  text "K40" at 507.13,718.98 h25
  text "K43" at 625.24,718.98 h25
  text "K44" at 664.61,718.98 h25
  text "K45" at 703.98,718.98 h25
  text "K49" at 861.46,718.98 h25
  text "K50" at 900.83,718.98 h25
  text "K53" at 1018.94,718.98 h25
  text "K54" at 1058.31,718.98 h25
  text "L1" at -1028.31,669.61 h25
  text "L2" at -988.94,669.61 h25
  text "L3" at -949.57,669.61 h25
  text "L4" at -910.2,669.61 h25
  text "L5" at -870.83,669.61 h25
  text "L8" at -752.72,669.61 h25
  text "L12" at -595.24,679.61 h25
  text "L13" at -555.87,679.61 h25
  text "L14" at -516.5,679.61 h25
  text "L17" at -398.39,679.61 h25
  text "L22" at -201.53,679.61 h25
  text "L27" at -4.68,679.61 h25
  text "L32" at 192.16,679.61 h25
  text "L37" at 389.02,679.61 h25
  text "L41" at 546.5,679.61 h25
  text "L42" at 585.87,679.61 h25
  text "L43" at 625.24,679.61 h25
  text "L47" at 782.72,679.61 h25
  text "L50" at 900.83,679.61 h25
  text "L51" at 940.2,679.61 h25
  text "L52" at 979.57,679.61 h25
  text "M1" at -1028.31,630.24 h25
  text "M2" at -988.94,630.24 h25
  text "M3" at -949.57,630.24 h25
  text "M4" at -910.2,630.24 h25
  text "M5" at -870.83,630.24 h25
  text "M6" at -831.46,630.24 h25
  text "M10" at -673.98,640.24 h25
  text "M14" at -516.5,640.24 h25
  text "M15" at -477.13,640.24 h25
  text "M16" at -437.76,640.24 h25
  text "M18" at -359.02,640.24 h25
  text "M20" at -280.28,640.24 h25
  text "M22" at -201.53,640.24 h25
  text "M24" at -122.8,640.24 h25
  text "M26" at -44.05,640.24 h25
  text "M28" at 34.69,640.24 h25
  text "M30" at 113.42,640.24 h25
  text "M32" at 192.16,640.24 h25
  text "M34" at 270.91,640.24 h25
  text "M36" at 349.65,640.24 h25
  text "M38" at 428.39,640.24 h25
  text "M39" at 467.76,640.24 h25
  text "M40" at 507.13,640.24 h25
  text "M41" at 546.5,640.24 h25
  text "M45" at 703.98,640.24 h25
  text "M49" at 861.46,640.24 h25
  text "M50" at 900.83,640.24 h25
  text "M51" at 940.2,640.24 h25
  text "M52" at 979.57,640.24 h25
  text "M53" at 1018.94,640.24 h25
  text "M54" at 1058.31,640.24 h25
  text "N1" at -1028.31,590.87 h25
  text "N2" at -988.94,590.87 h25
  text "N3" at -949.57,590.87 h25
  text "N4" at -910.2,590.87 h25
  text "N5" at -870.83,590.87 h25
  text "N8" at -752.72,590.87 h25
  text "N12" at -595.24,600.87 h25
  text "N16" at -437.76,600.87 h25
  text "N17" at -398.39,600.87 h25
  text "N19" at -319.65,600.87 h25
  text "N21" at -240.91,600.87 h25
  text "N23" at -162.16,600.87 h25
  text "N25" at -83.42,600.87 h25
  text "N27" at -4.68,600.87 h25
  text "N29" at 74.06,600.87 h25
  text "N31" at 152.79,600.87 h25
  text "N33" at 231.53,600.87 h25
  text "N35" at 310.28,600.87 h25
  text "N37" at 389.02,600.87 h25
  text "N39" at 467.76,600.87 h25
  text "N43" at 625.24,600.87 h25
  text "N47" at 782.72,600.87 h25
  text "N50" at 900.83,600.87 h25
  text "N51" at 940.2,600.87 h25
  text "N52" at 979.57,600.87 h25
  text "N53" at 1018.94,600.87 h25
  text "N54" at 1058.31,600.87 h25
  text "P1" at -1028.31,551.5 h25
  text "P2" at -988.94,551.5 h25
  text "P3" at -949.57,551.5 h25
  text "P4" at -910.2,551.5 h25
  text "P5" at -870.83,551.5 h25
  text "P6" at -831.46,551.5 h25
  text "P7" at -792.09,551.5 h25
  text "P10" at -673.98,561.5 h25
  text "P14" at -516.5,561.5 h25
  text "P16" at -437.76,561.5 h25
  text "P18" at -359.02,561.5 h25
  text "P20" at -280.28,561.5 h25
  text "P22" at -201.53,561.5 h25
  text "P24" at -122.8,561.5 h25
  text "P26" at -44.05,561.5 h25
  text "P28" at 34.69,561.5 h25
  text "P30" at 113.42,561.5 h25
  text "P32" at 192.16,561.5 h25
  text "P34" at 270.91,561.5 h25
  text "P36" at 349.65,561.5 h25
  text "P38" at 428.39,561.5 h25
  text "P39" at 467.76,561.5 h25
  text "P41" at 546.5,561.5 h25
  text "P45" at 703.98,561.5 h25
  text "P48" at 822.09,561.5 h25
  text "P49" at 861.46,561.5 h25
  text "P50" at 900.83,561.5 h25
  text "P51" at 940.2,561.5 h25
  text "P52" at 979.57,561.5 h25
  text "P53" at 1018.94,561.5 h25
  text "P54" at 1058.31,561.5 h25
  text "R1" at -1028.31,512.13 h25
  text "R2" at -988.94,512.13 h25
  text "R3" at -949.57,512.13 h25
  text "R4" at -910.2,512.13 h25
  text "R5" at -870.83,512.13 h25
  text "R6" at -831.46,512.13 h25
  text "R7" at -792.09,512.13 h25
  text "R8" at -752.72,512.13 h25
  text "R12" at -595.24,522.13 h25
  text "R16" at -437.76,522.13 h25
  text "R17" at -398.39,522.13 h25
  text "R19" at -319.65,522.13 h25
  text "R21" at -240.91,522.13 h25
  text "R23" at -162.16,522.13 h25
  text "R25" at -83.42,522.13 h25
  text "R27" at -4.68,522.13 h25
  text "R29" at 74.06,522.13 h25
  text "R31" at 152.79,522.13 h25
  text "R33" at 231.53,522.13 h25
  text "R35" at 310.28,522.13 h25
  text "R37" at 389.02,522.13 h25
  text "R39" at 467.76,522.13 h25
  text "R43" at 625.24,522.13 h25
  text "R47" at 782.72,522.13 h25
  text "R48" at 822.09,522.13 h25
  text "R49" at 861.46,522.13 h25
  text "R50" at 900.83,522.13 h25
  text "R51" at 940.2,522.13 h25
  text "R52" at 979.57,522.13 h25
  text "T1" at -1028.31,472.76 h25
  text "T2" at -988.94,472.76 h25
  text "T3" at -949.57,472.76 h25
  text "T4" at -910.2,472.76 h25
  text "T5" at -870.83,472.76 h25
  text "T6" at -831.46,472.76 h25
  text "T7" at -792.09,472.76 h25
  text "T10" at -673.98,482.76 h25
  text "T14" at -516.5,482.76 h25
  text "T16" at -437.76,482.76 h25
  text "T18" at -359.02,482.76 h25
  text "T20" at -280.28,482.76 h25
  text "T22" at -201.53,482.76 h25
  text "T24" at -122.8,482.76 h25
  text "T26" at -44.05,482.76 h25
  text "T28" at 34.69,482.76 h25
  text "T30" at 113.42,482.76 h25
  text "T32" at 192.16,482.76 h25
  text "T34" at 270.91,482.76 h25
  text "T36" at 349.65,482.76 h25
  text "T38" at 428.39,482.76 h25
  text "T39" at 467.76,482.76 h25
  text "T41" at 546.5,482.76 h25
  text "T45" at 703.98,482.76 h25
  text "T48" at 822.09,482.76 h25
  text "T49" at 861.46,482.76 h25
  text "T50" at 900.83,482.76 h25
  text "T53" at 1018.94,482.76 h25
  text "T54" at 1058.31,482.76 h25
  text "U1" at -1028.31,433.39 h25
  text "U2" at -988.94,433.39 h25
  text "U3" at -949.57,433.39 h25
  text "U4" at -910.2,433.39 h25
  text "U5" at -870.83,433.39 h25
  text "U6" at -831.46,433.39 h25
  text "U7" at -792.09,433.39 h25
  text "U8" at -752.72,433.39 h25
  text "U12" at -595.24,443.39 h25
  text "U16" at -437.76,443.39 h25
  text "U17" at -398.39,443.39 h25
  text "U19" at -319.65,443.39 h25
  text "U21" at -240.91,443.39 h25
  text "U23" at -162.16,443.39 h25
  text "U25" at -83.42,443.39 h25
  text "U27" at -4.68,443.39 h25
  text "U29" at 74.06,443.39 h25
  text "U31" at 152.79,443.39 h25
  text "U33" at 231.53,443.39 h25
  text "U35" at 310.28,443.39 h25
  text "U37" at 389.02,443.39 h25
  text "U39" at 467.76,443.39 h25
  text "U43" at 625.24,443.39 h25
  text "U47" at 782.72,443.39 h25
  text "U48" at 822.09,443.39 h25
  text "U51" at 940.2,443.39 h25
  text "U52" at 979.57,443.39 h25
  text "V1" at -1028.31,394.02 h25
  text "V2" at -988.94,394.02 h25
  text "V3" at -949.57,394.02 h25
  text "V4" at -910.2,394.02 h25
  text "V5" at -870.83,394.02 h25
  text "V6" at -831.46,394.02 h25
  text "V7" at -792.09,394.02 h25
  text "V10" at -673.98,404.02 h25
  text "V14" at -516.5,404.02 h25
  text "V16" at -437.76,404.02 h25
  text "V18" at -359.02,404.02 h25
  text "V20" at -280.28,404.02 h25
  text "V22" at -201.53,404.02 h25
  text "V24" at -122.8,404.02 h25
  text "V26" at -44.05,404.02 h25
  text "V28" at 34.69,404.02 h25
  text "V30" at 113.42,404.02 h25
  text "V32" at 192.16,404.02 h25
  text "V34" at 270.91,404.02 h25
  text "V36" at 349.65,404.02 h25
  text "V38" at 428.39,404.02 h25
  text "V39" at 467.76,404.02 h25
  text "V41" at 546.5,404.02 h25
  text "V45" at 703.98,404.02 h25
  text "V48" at 822.09,404.02 h25
  text "V49" at 861.46,404.02 h25
  text "V50" at 900.83,404.02 h25
  text "V53" at 1018.94,404.02 h25
  text "V54" at 1058.31,404.02 h25
  text "W1" at -1028.31,354.65 h25
  text "W2" at -988.94,354.65 h25
  text "W3" at -949.57,354.65 h25
  text "W4" at -910.2,354.65 h25
  text "W5" at -870.83,354.65 h25
  text "W8" at -752.72,354.65 h25
  text "W12" at -595.24,364.65 h25
  text "W16" at -437.76,364.65 h25
  text "W17" at -398.39,364.65 h25
  text "W19" at -319.65,364.65 h25
  text "W21" at -240.91,364.65 h25
  text "W23" at -162.16,364.65 h25
  text "W25" at -83.42,364.65 h25
  text "W27" at -4.68,364.65 h25
  text "W29" at 74.06,364.65 h25
  text "W31" at 152.79,364.65 h25
  text "W33" at 231.53,364.65 h25
  text "W35" at 310.28,364.65 h25
  text "W37" at 389.02,364.65 h25
  text "W39" at 467.76,364.65 h25
  text "W43" at 625.24,364.65 h25
  text "W47" at 782.72,364.65 h25
  text "W50" at 900.83,364.65 h25
  text "W51" at 940.2,364.65 h25
  text "W52" at 979.57,364.65 h25
  text "Y1" at -1028.31,315.28 h25
  text "Y2" at -988.94,315.28 h25
  text "Y3" at -949.57,315.28 h25
  text "Y4" at -910.2,315.28 h25
  text "Y5" at -870.83,315.28 h25
  text "Y6" at -831.46,315.28 h25
  text "Y10" at -673.98,325.28 h25
  text "Y14" at -516.5,325.28 h25
  text "Y16" at -437.76,325.28 h25
  text "Y18" at -359.02,325.28 h25
  text "Y20" at -280.28,325.28 h25
  text "Y22" at -201.53,325.28 h25
  text "Y24" at -122.8,325.28 h25
  text "Y26" at -44.05,325.28 h25
  text "Y28" at 34.69,325.28 h25
  text "Y30" at 113.42,325.28 h25
  text "Y32" at 192.16,325.28 h25
  text "Y34" at 270.91,325.28 h25
  text "Y36" at 349.65,325.28 h25
  text "Y38" at 428.39,325.28 h25
  text "Y39" at 467.76,325.28 h25
  text "Y41" at 546.5,325.28 h25
  text "Y45" at 703.98,325.28 h25
  text "Y49" at 861.46,325.28 h25
  text "Y50" at 900.83,325.28 h25
  text "Y53" at 1018.94,325.28 h25
  text "Y54" at 1058.31,325.28 h25
  text "AA1" at -1028.31,285.91 h25
  text "AA2" at -988.94,285.91 h25
  text "AA3" at -949.57,285.91 h25
  text "AA4" at -910.2,285.91 h25
  text "AA5" at -870.83,285.91 h25
  text "AA8" at -752.72,285.91 h25
  text "AA12" at -595.24,295.91 h25
  text "AA16" at -437.76,295.91 h25
  text "AA17" at -398.39,295.91 h25
  text "AA19" at -319.65,295.91 h25
  text "AA21" at -240.91,295.91 h25
  text "AA23" at -162.16,295.91 h25
  text "AA25" at -83.42,295.91 h25
  text "AA27" at -4.68,295.91 h25
  text "AA29" at 74.06,295.91 h25
  text "AA31" at 152.79,295.91 h25
  text "AA33" at 231.53,295.91 h25
  text "AA35" at 310.28,295.91 h25
  text "AA37" at 389.02,295.91 h25
  text "AA39" at 467.76,295.91 h25
  text "AA43" at 625.24,295.91 h25
  text "AA47" at 782.72,295.91 h25
  text "AA50" at 900.83,295.91 h25
  text "AA51" at 940.2,295.91 h25
  text "AA52" at 979.57,295.91 h25
  text "AB1" at -1028.31,246.53 h25
  text "AB2" at -988.94,246.53 h25
  text "AB3" at -949.57,246.53 h25
  text "AB4" at -910.2,246.53 h25
  text "AB5" at -870.83,246.53 h25
  text "AB6" at -831.46,246.53 h25
  text "AB7" at -792.09,246.53 h25
  text "AB10" at -673.98,256.54 h25
  text "AB14" at -516.5,256.54 h25
  text "AB16" at -437.76,256.54 h25
  text "AB18" at -359.02,256.54 h25
  text "AB20" at -280.28,256.54 h25
  text "AB22" at -201.53,256.54 h25
  text "AB24" at -122.8,256.54 h25
  text "AB26" at -44.05,256.54 h25
  text "AB30" at 113.42,256.54 h25
  text "AB32" at 192.16,256.54 h25
  text "AB34" at 270.91,256.54 h25
  text "AB36" at 349.65,256.54 h25
  text "AB38" at 428.39,256.54 h25
  text "AB39" at 467.76,256.54 h25
  text "AB41" at 546.5,256.54 h25
  text "AB45" at 703.98,256.54 h25
  text "AB48" at 822.09,256.54 h25
  text "AB49" at 861.46,256.54 h25
  text "AB50" at 900.83,256.54 h25
  text "AB51" at 940.2,256.54 h25
  text "AB52" at 979.57,256.54 h25
  text "AB53" at 1018.94,256.54 h25
  text "AB54" at 1058.31,256.54 h25
  text "AC1" at -1028.31,207.16 h25
  text "AC2" at -988.94,207.16 h25
  text "AC3" at -949.57,207.16 h25
  text "AC4" at -910.2,207.16 h25
  text "AC5" at -870.83,207.16 h25
  text "AC6" at -831.46,207.16 h25
  text "AC7" at -792.09,207.16 h25
  text "AC8" at -752.72,207.16 h25
  text "AC12" at -595.24,217.16 h25
  text "AC16" at -437.76,217.16 h25
  text "AC17" at -398.39,217.16 h25
  text "AC19" at -319.65,217.16 h25
  text "AC21" at -240.91,217.16 h25
  text "AC23" at -162.16,217.16 h25
  text "AC25" at -83.42,217.16 h25
  text "AC27" at -4.68,217.16 h25
  text "AC29" at 74.06,217.16 h25
  text "AC31" at 152.79,217.16 h25
  text "AC33" at 231.53,217.16 h25
  text "AC35" at 310.28,217.16 h25
  text "AC37" at 389.02,217.16 h25
  text "AC39" at 467.76,217.16 h25
  text "AC43" at 625.24,217.16 h25
  text "AC47" at 782.72,217.16 h25
  text "AC48" at 822.09,217.16 h25
  text "AC49" at 861.46,217.16 h25
  text "AC50" at 900.83,217.16 h25
  text "AC51" at 940.2,217.16 h25
  text "AC52" at 979.57,217.16 h25
  text "AC53" at 1018.94,217.16 h25
  text "AC54" at 1058.31,217.16 h25
  text "AD1" at -1028.31,167.79 h25
  text "AD2" at -988.94,167.79 h25
  text "AD3" at -949.57,167.79 h25
  text "AD4" at -910.2,167.79 h25
  text "AD5" at -870.83,167.79 h25
  text "AD6" at -831.46,167.79 h25
  text "AD7" at -792.09,167.79 h25
  text "AD10" at -673.98,177.79 h25
  text "AD14" at -516.5,177.79 h25
  text "AD16" at -437.76,177.79 h25
  text "AD18" at -359.02,177.79 h25
  text "AD20" at -280.28,177.79 h25
  text "AD22" at -201.53,177.79 h25
  text "AD24" at -122.8,177.79 h25
  text "AD26" at -44.05,177.79 h25
  text "AD28" at 34.69,177.79 h25
  text "AD30" at 113.42,177.79 h25
  text "AD32" at 192.16,177.79 h25
  text "AD34" at 270.91,177.79 h25
  text "AD36" at 349.65,177.79 h25
  text "AD38" at 428.39,177.79 h25
  text "AD39" at 467.76,177.79 h25
  text "AD41" at 546.5,177.79 h25
  text "AD45" at 703.98,177.79 h25
  text "AD48" at 822.09,177.79 h25
  text "AD49" at 861.46,177.79 h25
  text "AD50" at 900.83,177.79 h25
  text "AD51" at 940.2,177.79 h25
  text "AD52" at 979.57,177.79 h25
  text "AD53" at 1018.94,177.79 h25
  text "AD54" at 1058.31,177.79 h25
  text "AE1" at -1028.31,128.43 h25
  text "AE2" at -988.94,128.43 h25
  text "AE3" at -949.57,128.43 h25
  text "AE4" at -910.2,128.43 h25
  text "AE5" at -870.83,128.43 h25
  text "AE6" at -831.46,128.43 h25
  text "AE7" at -792.09,128.43 h25
  text "AE8" at -752.72,128.43 h25
  text "AE12" at -595.24,138.43 h25
  text "AE16" at -437.76,138.43 h25
  text "AE17" at -398.39,138.43 h25
  text "AE19" at -319.65,138.43 h25
  text "AE21" at -240.91,138.43 h25
  text "AE23" at -162.16,138.43 h25
  text "AE25" at -83.42,138.43 h25
  text "AE29" at 74.06,138.43 h25
  text "AE31" at 152.79,138.43 h25
  text "AE33" at 231.53,138.43 h25
  text "AE35" at 310.28,138.43 h25
  text "AE37" at 389.02,138.43 h25
  text "AE39" at 467.76,138.43 h25
  text "AE43" at 625.24,138.43 h25
  text "AE47" at 782.72,138.43 h25
  text "AE48" at 822.09,138.43 h25
  text "AE51" at 940.2,138.43 h25
  text "AE52" at 979.57,138.43 h25
  text "AF1" at -1028.31,89.06 h25
  text "AF2" at -988.94,89.06 h25
  text "AF3" at -949.57,89.06 h25
  text "AF4" at -910.2,89.06 h25
  text "AF5" at -870.83,89.06 h25
  text "AF6" at -831.46,89.06 h25
  text "AF7" at -792.09,89.06 h25
  text "AF10" at -673.98,99.06 h25
  text "AF14" at -516.5,99.06 h25
  text "AF16" at -437.76,99.06 h25
  text "AF18" at -359.02,99.06 h25
  text "AF20" at -280.28,99.06 h25
  text "AF22" at -201.53,99.06 h25
  text "AF24" at -122.8,99.06 h25
  text "AF26" at -44.05,99.06 h25
  text "AF28" at 34.69,99.06 h25
  text "AF30" at 113.42,99.06 h25
  text "AF32" at 192.16,99.06 h25
  text "AF34" at 270.91,99.06 h25
  text "AF36" at 349.65,99.06 h25
  text "AF38" at 428.39,99.06 h25
  text "AF39" at 467.76,99.06 h25
  text "AF41" at 546.5,99.06 h25
  text "AF45" at 703.98,99.06 h25
  text "AF48" at 822.09,99.06 h25
  text "AF49" at 861.46,99.06 h25
  text "AF50" at 900.83,99.06 h25
  text "AF53" at 1018.94,99.06 h25
  text "AF54" at 1058.31,99.06 h25
  text "AG1" at -1028.31,49.69 h25
  text "AG2" at -988.94,49.69 h25
  text "AG3" at -949.57,49.69 h25
  text "AG4" at -910.2,49.69 h25
  text "AG5" at -870.83,49.69 h25
  text "AG8" at -752.72,49.69 h25
  text "AG12" at -595.24,59.69 h25
  text "AG16" at -437.76,59.69 h25
  text "AG17" at -398.39,59.69 h25
  text "AG19" at -319.65,59.69 h25
  text "AG21" at -240.91,59.69 h25
  text "AG23" at -162.16,59.69 h25
  text "AG25" at -83.42,59.69 h25
  text "AG27" at -4.68,59.69 h25
  text "AG29" at 74.06,59.69 h25
  text "AG31" at 152.79,59.69 h25
  text "AG33" at 231.53,59.69 h25
  text "AG35" at 310.28,59.69 h25
  text "AG37" at 389.02,59.69 h25
  text "AG39" at 467.76,59.69 h25
  text "AG43" at 625.24,59.69 h25
  text "AG47" at 782.72,59.69 h25
  text "AG50" at 900.83,59.69 h25
  text "AG51" at 940.2,59.69 h25
  text "AG52" at 979.57,59.69 h25
  text "AH1" at -1028.31,10.31 h25
  text "AH2" at -988.94,10.31 h25
  text "AH3" at -949.57,10.31 h25
  text "AH4" at -910.2,10.31 h25
  text "AH5" at -870.83,10.31 h25
  text "AH6" at -831.46,10.31 h25
  text "AH7" at -792.09,10.31 h25
  text "AH10" at -673.98,20.32 h25
  text "AH14" at -516.5,20.32 h25
  text "AH16" at -437.76,20.32 h25
  text "AH18" at -359.02,20.32 h25
  text "AH20" at -280.28,20.32 h25
  text "AH22" at -201.53,20.32 h25
  text "AH24" at -122.8,20.32 h25
  text "AH26" at -44.05,20.32 h25
  text "AH28" at 34.69,20.32 h25
  text "AH30" at 113.42,20.32 h25
  text "AH32" at 192.16,20.32 h25
  text "AH34" at 270.91,20.32 h25
  text "AH36" at 349.65,20.32 h25
  text "AH38" at 428.39,20.32 h25
  text "AH39" at 467.76,20.32 h25
  text "AH41" at 546.5,20.32 h25
  text "AH45" at 703.98,20.32 h25
  text "AH48" at 822.09,20.32 h25
  text "AH49" at 861.46,20.32 h25
  text "AH50" at 900.83,20.32 h25
  text "AH53" at 1018.94,20.32 h25
  text "AH54" at 1058.31,20.32 h25
  text "AJ1" at -1028.31,-29.05 h25
  text "AJ2" at -988.94,-29.05 h25
  text "AJ3" at -949.57,-29.05 h25
  text "AJ4" at -910.2,-29.05 h25
  text "AJ5" at -870.83,-29.05 h25
  text "AJ8" at -752.72,-29.05 h25
  text "AJ12" at -595.24,-19.05 h25
  text "AJ16" at -437.76,-19.05 h25
  text "AJ17" at -398.39,-19.05 h25
  text "AJ19" at -319.65,-19.05 h25
  text "AJ21" at -240.91,-19.05 h25
  text "AJ23" at -162.16,-19.05 h25
  text "AJ25" at -83.42,-19.05 h25
  text "AJ27" at -4.68,-19.05 h25
  text "AJ29" at 74.06,-19.05 h25
  text "AJ31" at 152.79,-19.05 h25
  text "AJ33" at 231.53,-19.05 h25
  text "AJ35" at 310.28,-19.05 h25
  text "AJ37" at 389.02,-19.05 h25
  text "AJ39" at 467.76,-19.05 h25
  text "AJ43" at 625.24,-19.05 h25
  text "AJ47" at 782.72,-19.05 h25
  text "AJ50" at 900.83,-19.05 h25
  text "AJ51" at 940.2,-19.05 h25
  text "AJ52" at 979.57,-19.05 h25
  text "AK1" at -1028.31,-68.42 h25
  text "AK2" at -988.94,-68.42 h25
  text "AK3" at -949.57,-68.42 h25
  text "AK4" at -910.2,-68.42 h25
  text "AK5" at -870.83,-68.42 h25
  text "AK6" at -831.46,-68.42 h25
  text "AK7" at -792.09,-68.42 h25
  text "AK10" at -673.98,-58.42 h25
  text "AK14" at -516.5,-58.42 h25
  text "AK16" at -437.76,-58.42 h25
  text "AK18" at -359.02,-58.42 h25
  text "AK20" at -280.28,-58.42 h25
  text "AK22" at -201.53,-58.42 h25
  text "AK24" at -122.8,-58.42 h25
  text "AK26" at -44.05,-58.42 h25
  text "AK28" at 34.69,-58.42 h25
  text "AK30" at 113.42,-58.42 h25
  text "AK32" at 192.16,-58.42 h25
  text "AK34" at 270.91,-58.42 h25
  text "AK36" at 349.65,-58.42 h25
  text "AK38" at 428.39,-58.42 h25
  text "AK39" at 467.76,-58.42 h25
  text "AK41" at 546.5,-58.42 h25
  text "AK45" at 703.98,-58.42 h25
  text "AK48" at 822.09,-58.42 h25
  text "AK49" at 861.46,-58.42 h25
  text "AK50" at 900.83,-58.42 h25
  text "AK53" at 1018.94,-58.42 h25
  text "AK54" at 1058.31,-58.42 h25
  text "AL3" at -949.57,-107.8 h25
  text "AL4" at -910.2,-107.8 h25
  text "AL5" at -870.83,-107.8 h25
  text "AL6" at -831.46,-107.8 h25
  text "AL7" at -792.09,-107.8 h25
  text "AL8" at -752.72,-107.8 h25
  text "AL12" at -595.24,-97.8 h25
  text "AL16" at -437.76,-97.8 h25
  text "AL17" at -398.39,-97.8 h25
  text "AL19" at -319.65,-97.8 h25
  text "AL21" at -240.91,-97.8 h25
  text "AL23" at -162.16,-97.8 h25
  text "AL25" at -83.42,-97.8 h25
  text "AL27" at -4.68,-97.8 h25
  text "AL29" at 74.06,-97.8 h25
  text "AL31" at 152.79,-97.8 h25
  text "AL33" at 231.53,-97.8 h25
  text "AL35" at 310.28,-97.8 h25
  text "AL37" at 389.02,-97.8 h25
  text "AL39" at 467.76,-97.8 h25
  text "AL43" at 625.24,-97.8 h25
  text "AL47" at 782.72,-97.8 h25
  text "AL48" at 822.09,-97.8 h25
  text "AL51" at 940.2,-97.8 h25
  text "AL52" at 979.57,-97.8 h25
  text "AM1" at -1028.31,-147.16 h25
  text "AM2" at -988.94,-147.16 h25
  text "AM5" at -870.83,-147.16 h25
  text "AM6" at -831.46,-147.16 h25
  text "AM10" at -673.98,-137.16 h25
  text "AM14" at -516.5,-137.16 h25
  text "AM16" at -437.76,-137.16 h25
  text "AM18" at -359.02,-137.16 h25
  text "AM20" at -280.28,-137.16 h25
  text "AM22" at -201.53,-137.16 h25
  text "AM24" at -122.8,-137.16 h25
  text "AM26" at -44.05,-137.16 h25
  text "AM28" at 34.69,-137.16 h25
  text "AM30" at 113.42,-137.16 h25
  text "AM32" at 192.16,-137.16 h25
  text "AM34" at 270.91,-137.16 h25
  text "AM36" at 349.65,-137.16 h25
  text "AM38" at 428.39,-137.16 h25
  text "AM39" at 467.76,-137.16 h25
  text "AM41" at 546.5,-137.16 h25
  text "AM45" at 703.98,-137.16 h25
  text "AM48" at 822.09,-137.16 h25
  text "AM49" at 861.46,-137.16 h25
  text "AM50" at 900.83,-137.16 h25
  text "AM53" at 1018.94,-137.16 h25
  text "AM54" at 1058.31,-137.16 h25
  text "AN3" at -949.57,-186.53 h25
  text "AN4" at -910.2,-186.53 h25
  text "AN7" at -792.09,-186.53 h25
  text "AN8" at -752.72,-186.53 h25
  text "AN12" at -595.24,-176.53 h25
  text "AN16" at -437.76,-176.53 h25
  text "AN17" at -398.39,-176.53 h25
  text "AN19" at -319.65,-176.53 h25
  text "AN21" at -240.91,-176.53 h25
  text "AN23" at -162.16,-176.53 h25
  text "AN25" at -83.42,-176.53 h25
  text "AN27" at -4.68,-176.53 h25
  text "AN29" at 74.06,-176.53 h25
  text "AN31" at 152.79,-176.53 h25
  text "AN33" at 231.53,-176.53 h25
  text "AN35" at 310.28,-176.53 h25
  text "AN37" at 389.02,-176.53 h25
  text "AN39" at 467.76,-176.53 h25
  text "AN43" at 625.24,-176.53 h25
  text "AN47" at 782.72,-176.53 h25
  text "AN48" at 822.09,-176.53 h25
  text "AN51" at 940.2,-176.53 h25
  text "AN52" at 979.57,-176.53 h25
  text "AP1" at -1028.31,-225.91 h25
  text "AP2" at -988.94,-225.91 h25
  text "AP5" at -870.83,-225.91 h25
  text "AP6" at -831.46,-225.91 h25
  text "AP7" at -792.09,-225.91 h25
  text "AP10" at -673.98,-215.91 h25
  text "AP14" at -516.5,-215.91 h25
  text "AP16" at -437.76,-215.91 h25
  text "AP18" at -359.02,-215.91 h25
  text "AP20" at -280.28,-215.91 h25
  text "AP22" at -201.53,-215.91 h25
  text "AP24" at -122.8,-215.91 h25
  text "AP26" at -44.05,-215.91 h25
  text "AP28" at 34.69,-215.91 h25
  text "AP30" at 113.42,-215.91 h25
  text "AP32" at 192.16,-215.91 h25
  text "AP34" at 270.91,-215.91 h25
  text "AP36" at 349.65,-215.91 h25
  text "AP38" at 428.39,-215.91 h25
  text "AP39" at 467.76,-215.91 h25
  text "AP41" at 546.5,-215.91 h25
  text "AP45" at 703.98,-215.91 h25
  text "AP48" at 822.09,-215.91 h25
  text "AP49" at 861.46,-215.91 h25
  text "AP50" at 900.83,-215.91 h25
  text "AP53" at 1018.94,-215.91 h25
  text "AP54" at 1058.31,-215.91 h25
  text "AR3" at -949.57,-265.28 h25
  text "AR4" at -910.2,-265.28 h25
  text "AR5" at -870.83,-265.28 h25
  text "AR8" at -752.72,-265.28 h25
  text "AR12" at -595.24,-255.28 h25
  text "AR16" at -437.76,-255.28 h25
  text "AR17" at -398.39,-255.28 h25
  text "AR19" at -319.65,-255.28 h25
  text "AR21" at -240.91,-255.28 h25
  text "AR23" at -162.16,-255.28 h25
  text "AR25" at -83.42,-255.28 h25
  text "AR27" at -4.68,-255.28 h25
  text "AR29" at 74.06,-255.28 h25
  text "AR31" at 152.79,-255.28 h25
  text "AR33" at 231.53,-255.28 h25
  text "AR35" at 310.28,-255.28 h25
  text "AR37" at 389.02,-255.28 h25
  text "AR39" at 467.76,-255.28 h25
  text "AR43" at 625.24,-255.28 h25
  text "AR47" at 782.72,-255.28 h25
  text "AR50" at 900.83,-255.28 h25
  text "AR51" at 940.2,-255.28 h25
  text "AR52" at 979.57,-255.28 h25
  text "AT1" at -1028.31,-304.65 h25
  text "AT2" at -988.94,-304.65 h25
  text "AT5" at -870.83,-304.65 h25
  text "AT6" at -831.46,-304.65 h25
  text "AT7" at -792.09,-304.65 h25
  text "AT10" at -673.98,-294.65 h25
  text "AT14" at -516.5,-294.65 h25
  text "AT16" at -437.76,-294.65 h25
  text "AT18" at -359.02,-294.65 h25
  text "AT20" at -280.28,-294.65 h25
  text "AT22" at -201.53,-294.65 h25
  text "AT24" at -122.8,-294.65 h25
  text "AT26" at -44.05,-294.65 h25
  text "AT28" at 34.69,-294.65 h25
  text "AT30" at 113.42,-294.65 h25
  text "AT32" at 192.16,-294.65 h25
  text "AT34" at 270.91,-294.65 h25
  text "AT36" at 349.65,-294.65 h25
  text "AT38" at 428.39,-294.65 h25
  text "AT39" at 467.76,-294.65 h25
  text "AT41" at 546.5,-294.65 h25
  text "AT45" at 703.98,-294.65 h25
  text "AT48" at 822.09,-294.65 h25
  text "AT49" at 861.46,-294.65 h25
  text "AT50" at 900.83,-294.65 h25
  text "AT53" at 1018.94,-294.65 h25
  text "AT54" at 1058.31,-294.65 h25
  text "AU3" at -949.57,-344.02 h25
  text "AU4" at -910.2,-344.02 h25
  text "AU5" at -870.83,-344.02 h25
  text "AU8" at -752.72,-344.02 h25
  text "AU12" at -595.24,-334.02 h25
  text "AU16" at -437.76,-334.02 h25
  text "AU17" at -398.39,-334.02 h25
  text "AU19" at -319.65,-334.02 h25
  text "AU21" at -240.91,-334.02 h25
  text "AU23" at -162.16,-334.02 h25
  text "AU25" at -83.42,-334.02 h25
  text "AU27" at -4.68,-334.02 h25
  text "AU29" at 74.06,-334.02 h25
  text "AU31" at 152.79,-334.02 h25
  text "AU33" at 231.53,-334.02 h25
  text "AU35" at 310.28,-334.02 h25
  text "AU37" at 389.02,-334.02 h25
  text "AU39" at 467.76,-334.02 h25
  text "AU43" at 625.24,-334.02 h25
  text "AU47" at 782.72,-334.02 h25
  text "AU50" at 900.83,-334.02 h25
  text "AU51" at 940.2,-334.02 h25
  text "AU52" at 979.57,-334.02 h25
  text "AV1" at -1028.31,-383.39 h25
  text "AV2" at -988.94,-383.39 h25
  text "AV5" at -870.83,-383.39 h25
  text "AV6" at -831.46,-383.39 h25
  text "AV7" at -792.09,-383.39 h25
  text "AV10" at -673.98,-373.39 h25
  text "AV14" at -516.5,-373.39 h25
  text "AV15" at -477.13,-373.39 h25
  text "AV16" at -437.76,-373.39 h25
  text "AV18" at -359.02,-373.39 h25
  text "AV20" at -280.28,-373.39 h25
  text "AV22" at -201.53,-373.39 h25
  text "AV24" at -122.8,-373.39 h25
  text "AV26" at -44.05,-373.39 h25
  text "AV28" at 34.69,-373.39 h25
  text "AV30" at 113.42,-373.39 h25
  text "AV32" at 192.16,-373.39 h25
  text "AV34" at 270.91,-373.39 h25
  text "AV36" at 349.65,-373.39 h25
  text "AV38" at 428.39,-373.39 h25
  text "AV39" at 467.76,-373.39 h25
  text "AV40" at 507.13,-373.39 h25
  text "AV41" at 546.5,-373.39 h25
  text "AV45" at 703.98,-373.39 h25
  text "AV48" at 822.09,-373.39 h25
  text "AV49" at 861.46,-373.39 h25
  text "AV50" at 900.83,-373.39 h25
  text "AV53" at 1018.94,-373.39 h25
  text "AV54" at 1058.31,-373.39 h25
  text "AW3" at -949.57,-422.76 h25
  text "AW4" at -910.2,-422.76 h25
  text "AW7" at -792.09,-422.76 h25
  text "AW8" at -752.72,-422.76 h25
  text "AW12" at -595.24,-412.76 h25
  text "AW13" at -555.87,-412.76 h25
  text "AW14" at -516.5,-412.76 h25
  text "AW17" at -398.39,-412.76 h25
  text "AW19" at -319.65,-412.76 h25
  text "AW21" at -240.91,-412.76 h25
  text "AW23" at -162.16,-412.76 h25
  text "AW25" at -83.42,-412.76 h25
  text "AW27" at -4.68,-412.76 h25
  text "AW29" at 74.06,-412.76 h25
  text "AW31" at 152.79,-412.76 h25
  text "AW33" at 231.53,-412.76 h25
  text "AW35" at 310.28,-412.76 h25
  text "AW37" at 389.02,-412.76 h25
  text "AW39" at 467.76,-412.76 h25
  text "AW41" at 546.5,-412.76 h25
  text "AW42" at 585.87,-412.76 h25
  text "AW43" at 625.24,-412.76 h25
  text "AW47" at 782.72,-412.76 h25
  text "AW48" at 822.09,-412.76 h25
  text "AW51" at 940.2,-412.76 h25
  text "AW52" at 979.57,-412.76 h25
  text "AY1" at -1028.31,-462.13 h25
  text "AY2" at -988.94,-462.13 h25
  text "AY5" at -870.83,-462.13 h25
  text "AY6" at -831.46,-462.13 h25
  text "AY7" at -792.09,-462.13 h25
  text "AY10" at -673.98,-452.13 h25
  text "AY12" at -595.24,-452.13 h25
  text "AY16" at -437.76,-452.13 h25
  text "AY18" at -359.02,-452.13 h25
  text "AY20" at -280.28,-452.13 h25
  text "AY22" at -201.53,-452.13 h25
  text "AY24" at -122.8,-452.13 h25
  text "AY26" at -44.05,-452.13 h25
  text "AY28" at 34.69,-452.13 h25
  text "AY30" at 113.42,-452.13 h25
  text "AY32" at 192.16,-452.13 h25
  text "AY34" at 270.91,-452.13 h25
  text "AY36" at 349.65,-452.13 h25
  text "AY38" at 428.39,-452.13 h25
  text "AY40" at 507.13,-452.13 h25
  text "AY43" at 625.24,-452.13 h25
  text "AY45" at 703.98,-452.13 h25
  text "AY48" at 822.09,-452.13 h25
  text "AY49" at 861.46,-452.13 h25
  text "AY50" at 900.83,-452.13 h25
  text "AY53" at 1018.94,-452.13 h25
  text "AY54" at 1058.31,-452.13 h25
  text "BA3" at -949.57,-501.5 h25
  text "BA4" at -910.2,-501.5 h25
  text "BA7" at -792.09,-501.5 h25
  text "BA8" at -752.72,-501.5 h25
  text "BA12" at -595.24,-491.5 h25
  text "BA17" at -398.39,-491.5 h25
  text "BA19" at -319.65,-491.5 h25
  text "BA21" at -240.91,-491.5 h25
  text "BA23" at -162.16,-491.5 h25
  text "BA25" at -83.42,-491.5 h25
  text "BA27" at -4.68,-491.5 h25
  text "BA29" at 74.06,-491.5 h25
  text "BA31" at 152.79,-491.5 h25
  text "BA33" at 231.53,-491.5 h25
  text "BA35" at 310.28,-491.5 h25
  text "BA37" at 389.02,-491.5 h25
  text "BA39" at 467.76,-491.5 h25
  text "BA43" at 625.24,-491.5 h25
  text "BA47" at 782.72,-491.5 h25
  text "BA48" at 822.09,-491.5 h25
  text "BA51" at 940.2,-491.5 h25
  text "BA52" at 979.57,-491.5 h25
  text "BB1" at -1028.31,-540.87 h25
  text "BB2" at -988.94,-540.87 h25
  text "BB5" at -870.83,-540.87 h25
  text "BB6" at -831.46,-540.87 h25
  text "BB7" at -792.09,-540.87 h25
  text "BB10" at -673.98,-530.87 h25
  text "BB12" at -595.24,-530.87 h25
  text "BB16" at -437.76,-530.87 h25
  text "BB18" at -359.02,-530.87 h25
  text "BB20" at -280.28,-530.87 h25
  text "BB22" at -201.53,-530.87 h25
  text "BB24" at -122.8,-530.87 h25
  text "BB26" at -44.05,-530.87 h25
  text "BB28" at 34.69,-530.87 h25
  text "BB30" at 113.42,-530.87 h25
  text "BB32" at 192.16,-530.87 h25
  text "BB34" at 270.91,-530.87 h25
  text "BB36" at 349.65,-530.87 h25
  text "BB38" at 428.39,-530.87 h25
  text "BB40" at 507.13,-530.87 h25
  text "BB43" at 625.24,-530.87 h25
  text "BB45" at 703.98,-530.87 h25
  text "BB48" at 822.09,-530.87 h25
  text "BB49" at 861.46,-530.87 h25
  text "BB50" at 900.83,-530.87 h25
  text "BB53" at 1018.94,-530.87 h25
  text "BB54" at 1058.31,-530.87 h25
  text "BC3" at -949.57,-580.24 h25
  text "BC4" at -910.2,-580.24 h25
  text "BC5" at -870.83,-580.24 h25
  text "BC8" at -752.72,-580.24 h25
  text "BC9" at -713.35,-580.24 h25
  text "BC12" at -595.24,-570.24 h25
  text "BC13" at -555.87,-570.24 h25
  text "BC14" at -516.5,-570.24 h25
  text "BC17" at -398.39,-570.24 h25
  text "BC19" at -319.65,-570.24 h25
  text "BC21" at -240.91,-570.24 h25
  text "BC23" at -162.16,-570.24 h25
  text "BC25" at -83.42,-570.24 h25
  text "BC27" at -4.68,-570.24 h25
  text "BC29" at 74.06,-570.24 h25
  text "BC31" at 152.79,-570.24 h25
  text "BC33" at 231.53,-570.24 h25
  text "BC35" at 310.28,-570.24 h25
  text "BC37" at 389.02,-570.24 h25
  text "BC39" at 467.76,-570.24 h25
  text "BC43" at 625.24,-570.24 h25
  text "BC46" at 743.35,-570.24 h25
  text "BC47" at 782.72,-570.24 h25
  text "BC50" at 900.83,-570.24 h25
  text "BC51" at 940.2,-570.24 h25
  text "BC52" at 979.57,-570.24 h25
  text "BD1" at -1028.31,-619.61 h25
  text "BD2" at -988.94,-619.61 h25
  text "BD3" at -949.57,-619.61 h25
  text "BD4" at -910.2,-619.61 h25
  text "BD5" at -870.83,-619.61 h25
  text "BD6" at -831.46,-619.61 h25
  text "BD7" at -792.09,-619.61 h25
  text "BD8" at -752.72,-619.61 h25
  text "BD9" at -713.35,-619.61 h25
  text "BD10" at -673.98,-609.61 h25
  text "BD11" at -634.61,-609.61 h25
  text "BD12" at -595.24,-609.61 h25
  text "BD16" at -437.76,-609.61 h25
  text "BD18" at -359.02,-609.61 h25
  text "BD20" at -280.28,-609.61 h25
  text "BD22" at -201.53,-609.61 h25
  text "BD24" at -122.8,-609.61 h25
  text "BD26" at -44.05,-609.61 h25
  text "BD28" at 34.69,-609.61 h25
  text "BD30" at 113.42,-609.61 h25
  text "BD32" at 192.16,-609.61 h25
  text "BD34" at 270.91,-609.61 h25
  text "BD36" at 349.65,-609.61 h25
  text "BD38" at 428.39,-609.61 h25
  text "BD40" at 507.13,-609.61 h25
  text "BD43" at 625.24,-609.61 h25
  text "BD44" at 664.61,-609.61 h25
  text "BD45" at 703.98,-609.61 h25
  text "BD46" at 743.35,-609.61 h25
  text "BD47" at 782.72,-609.61 h25
  text "BD48" at 822.09,-609.61 h25
  text "BD49" at 861.46,-609.61 h25
  text "BD50" at 900.83,-609.61 h25
  text "BD52" at 979.57,-609.61 h25
  text "BD53" at 1018.94,-609.61 h25
  text "BD54" at 1058.31,-609.61 h25
  text "BE2" at -988.94,-658.98 h25
  text "BE7" at -792.09,-658.98 h25
  text "BE12" at -595.24,-648.98 h25
  text "BE17" at -398.39,-648.98 h25
  text "BE19" at -319.65,-648.98 h25
  text "BE21" at -240.91,-648.98 h25
  text "BE23" at -162.16,-648.98 h25
  text "BE25" at -83.42,-648.98 h25
  text "BE27" at -4.68,-648.98 h25
  text "BE29" at 74.06,-648.98 h25
  text "BE31" at 152.79,-648.98 h25
  text "BE33" at 231.53,-648.98 h25
  text "BE35" at 310.28,-648.98 h25
  text "BE37" at 389.02,-648.98 h25
  text "BE39" at 467.76,-648.98 h25
  text "BE42" at 585.87,-648.98 h25
  text "BE47" at 782.72,-648.98 h25
  text "BE52" at 979.57,-648.98 h25
  text "BF9" at -713.35,-698.35 h25
  text "BF14" at -516.5,-688.35 h25
  text "BF19" at -319.65,-688.35 h25
  text "BF24" at -122.8,-688.35 h25
  text "BF29" at 74.06,-688.35 h25
  text "BF34" at 270.91,-688.35 h25
  text "BF39" at 467.76,-688.35 h25
  text "BF44" at 664.61,-688.35 h25
  text "BF49" at 861.46,-688.35 h25
  text "BF54" at 1058.31,-688.35 h25
  text "BG1" at -1028.31,-737.72 h25
  text "BG11" at -634.61,-727.72 h25
  text "BG16" at -437.76,-727.72 h25
  text "BG21" at -240.91,-727.72 h25
  text "BG31" at 152.79,-727.72 h25
  text "BG36" at 349.65,-727.72 h25
  text "BG46" at 743.35,-727.72 h25
  text "BH8" at -752.72,-777.09 h25
  text "BH18" at -359.02,-767.09 h25
  text "BH28" at 34.69,-767.09 h25
  text "BH38" at 428.39,-767.09 h25
  text "BH43" at 625.24,-767.09 h25
  text "BH53" at 1018.94,-767.09 h25
  text "BJ5" at -870.83,-816.46 h25
  text "BJ15" at -477.13,-806.46 h25
  text "BJ19" at -319.65,-806.46 h25
  text "BJ20" at -280.28,-806.46 h25
  text "BJ25" at -83.42,-806.46 h25
  text "BJ35" at 310.28,-806.46 h25
  text "BJ39" at 467.76,-806.46 h25
  text "BJ40" at 507.13,-806.46 h25
  text "BJ50" at 900.83,-806.46 h25
  text "BK2" at -988.94,-855.83 h25
  text "BK12" at -595.24,-845.83 h25
  text "BK17" at -398.39,-845.83 h25
  text "BK22" at -201.53,-845.83 h25
  text "BK32" at 192.16,-845.83 h25
  text "BK37" at 389.02,-845.83 h25
  text "BK47" at 782.72,-845.83 h25
  text "BK52" at 979.57,-845.83 h25
  text "BL1" at -1028.31,-895.2 h25
  text "BL9" at -713.35,-895.2 h25
  text "BL19" at -319.65,-885.2 h25
  text "BL24" at -122.8,-885.2 h25
  text "BL29" at 74.06,-885.2 h25
  text "BL39" at 467.76,-885.2 h25
  text "BL44" at 664.61,-885.2 h25
  text "BL54" at 1058.31,-885.2 h25
  text "BM2" at -988.94,-934.57 h25
  text "BM6" at -831.46,-934.57 h25
  text "BM11" at -634.61,-924.57 h25
  text "BM16" at -437.76,-924.57 h25
  text "BM21" at -240.91,-924.57 h25
  text "BM26" at -44.05,-924.57 h25
  text "BM31" at 152.79,-924.57 h25
  text "BM36" at 349.65,-924.57 h25
  text "BM41" at 546.5,-924.57 h25
  text "BM46" at 743.35,-924.57 h25
  text "BM51" at 940.2,-924.57 h25
  text "BM53" at 1018.94,-924.57 h25
  text "BN3" at -949.57,-973.94 h25
  text "BN8" at -752.72,-973.94 h25
  text "BN13" at -555.87,-963.94 h25
  text "BN18" at -359.02,-963.94 h25
  text "BN23" at -162.16,-963.94 h25
  text "BN28" at 34.69,-963.94 h25
  text "BN33" at 231.53,-963.94 h25
  text "BN38" at 428.39,-963.94 h25
  text "BN43" at 625.24,-963.94 h25
  text "BN48" at 822.09,-963.94 h25
  text "BN52" at 979.57,-963.94 h25
  text "BP4" at -910.2,-1013.31 h25
  text "BP5" at -870.83,-1013.31 h25
  text "BP10" at -673.98,-1003.31 h25
  text "BP15" at -477.13,-1003.31 h25
  text "BP25" at -83.42,-1003.31 h25
  text "BP30" at 113.42,-1003.31 h25
  text "BP35" at 310.28,-1003.31 h25
  text "BP40" at 507.13,-1003.31 h25
  text "BP45" at 703.98,-1003.31 h25
  text "BP50" at 900.83,-1003.31 h25
  text "BP51" at 940.2,-1003.31 h25
  text "BP20" at -280.28,-1003.31 h25
  text "BL4" at -910.2,-895.2 h25
  text "D53" at 1018.94,955.2 h25
  text "M11" at -634.61,640.24 h25
  text "M44" at 664.61,640.24 h25
  text "N13" at -555.87,600.87 h25
  text "N42" at 585.87,600.87 h25
  text "P11" at -634.61,561.5 h25
  text "P44" at 664.61,561.5 h25
  text "R13" at -555.87,522.13 h25
  text "R42" at 585.87,522.13 h25
  text "T11" at -634.61,482.76 h25
  text "T44" at 664.61,482.76 h25
  text "U13" at -555.87,443.39 h25
  text "U42" at 585.87,443.39 h25
  text "V11" at -634.61,404.02 h25
  text "V44" at 664.61,404.02 h25
  text "W13" at -555.87,364.65 h25
  text "W42" at 585.87,364.65 h25
  text "Y11" at -634.61,325.28 h25
  text "Y44" at 664.61,325.28 h25
  text "AA13" at -555.87,295.91 h25
  text "AA42" at 585.87,295.91 h25
  text "AB11" at -634.61,256.54 h25
  text "AB44" at 664.61,256.54 h25
  text "AC13" at -555.87,217.16 h25
  text "AC42" at 585.87,217.16 h25
  text "AD11" at -634.61,177.79 h25
  text "AD44" at 664.61,177.79 h25
  text "AE13" at -555.87,138.43 h25
  text "AE42" at 585.87,138.43 h25
  text "AG13" at -555.87,59.69 h25
  text "AG42" at 585.87,59.69 h25
  text "AJ13" at -555.87,-19.05 h25
  text "AJ42" at 585.87,-19.05 h25
  text "AL13" at -555.87,-97.8 h25
  text "AL42" at 585.87,-97.8 h25
  text "AM11" at -634.61,-137.16 h25
  text "AM44" at 664.61,-137.16 h25
  text "AN13" at -555.87,-176.53 h25
  text "AN42" at 585.87,-176.53 h25
  text "AP11" at -634.61,-215.91 h25
  text "AP44" at 664.61,-215.91 h25
  text "AR13" at -555.87,-255.28 h25
  text "AR42" at 585.87,-255.28 h25
  text "AT11" at -634.61,-294.65 h25
  text "AT44" at 664.61,-294.65 h25
  text "AU13" at -555.87,-334.02 h25
  text "AU42" at 585.87,-334.02 h25
  text "AV11" at -634.61,-373.39 h25
  text "AV44" at 664.61,-373.39 h25
  text "AU40" at 507.13,-334.02 h25
  text "AE40" at 507.13,138.43 h25
  text "AU15" at -477.13,-334.02 h25
  text "D7" at -792.09,945.2 h25
  text "D48" at 822.09,955.2 h25
  text "F7" at -792.09,866.46 h25
  text "F48" at 822.09,876.46 h25
  text "H7" at -792.09,787.72 h25
  text "H48" at 822.09,797.72 h25
  text "K7" at -792.09,708.98 h25
  text "K48" at 822.09,718.98 h25
  text "L9" at -713.35,669.61 h25
  text "L46" at 743.35,679.61 h25
  text "M7" at -792.09,630.24 h25
  text "M48" at 822.09,640.24 h25
  text "N9" at -713.35,590.87 h25
  text "N46" at 743.35,600.87 h25
  text "R9" at -713.35,512.13 h25
  text "R46" at 743.35,522.13 h25
  text "U9" at -713.35,433.39 h25
  text "U46" at 743.35,443.39 h25
  text "W9" at -713.35,354.65 h25
  text "W46" at 743.35,364.65 h25
  text "Y7" at -792.09,315.28 h25
  text "Y48" at 822.09,325.28 h25
  text "AA9" at -713.35,285.91 h25
  text "AA46" at 743.35,295.91 h25
  text "AC9" at -713.35,207.16 h25
  text "AC46" at 743.35,217.16 h25
  text "AE9" at -713.35,128.43 h25
  text "AE46" at 743.35,138.43 h25
  text "AF11" at -634.61,99.06 h25
  text "AF44" at 664.61,99.06 h25
  text "AG9" at -713.35,49.69 h25
  text "AG46" at 743.35,59.69 h25
  text "AH11" at -634.61,20.32 h25
  text "AH44" at 664.61,20.32 h25
  text "AJ9" at -713.35,-29.05 h25
  text "AJ46" at 743.35,-19.05 h25
  text "AK11" at -634.61,-58.42 h25
  text "AK44" at 664.61,-58.42 h25
  text "AL9" at -713.35,-107.8 h25
  text "AL46" at 743.35,-97.8 h25
  text "AN9" at -713.35,-186.53 h25
  text "AN46" at 743.35,-176.53 h25
  text "AR9" at -713.35,-265.28 h25
  text "AR46" at 743.35,-255.28 h25
  text "AU9" at -713.35,-344.02 h25
  text "AU46" at 743.35,-334.02 h25
  text "AW9" at -713.35,-422.76 h25
  text "AW46" at 743.35,-412.76 h25
  text "AY11" at -634.61,-452.13 h25
  text "AY44" at 664.61,-452.13 h25
  text "BA9" at -713.35,-501.5 h25
  text "BA46" at 743.35,-491.5 h25
  text "BB11" at -634.61,-530.87 h25
  text "BB44" at 664.61,-530.87 h25
  text "N15" at -477.13,600.87 h25
  text "AE15" at -477.13,138.43 h25
  text "N40" at 507.13,600.87 h25
  text "P15" at -477.13,561.5 h25
  text "P40" at 507.13,561.5 h25
  text "T15" at -477.13,482.76 h25
  text "T40" at 507.13,482.76 h25
  text "V15" at -477.13,404.02 h25
  text "V40" at 507.13,404.02 h25
  text "Y15" at -477.13,325.28 h25
  text "Y40" at 507.13,325.28 h25
  text "AB15" at -477.13,256.54 h25
  text "AB40" at 507.13,256.54 h25
  text "AD15" at -477.13,177.79 h25
  text "AD40" at 507.13,177.79 h25
  text "AF15" at -477.13,99.06 h25
  text "AF40" at 507.13,99.06 h25
  text "AH15" at -477.13,20.32 h25
  text "AH40" at 507.13,20.32 h25
  text "AK15" at -477.13,-58.42 h25
  text "AK40" at 507.13,-58.42 h25
  text "AM15" at -477.13,-137.16 h25
  text "AM40" at 507.13,-137.16 h25
  text "AP15" at -477.13,-215.91 h25
  text "AP40" at 507.13,-215.91 h25
  text "AT15" at -477.13,-294.65 h25
  text "AT40" at 507.13,-294.65 h25
  text "AD27" at -4.68,177.79 h25
  text "AC28" at 34.69,217.16 h25
  text "P37" at 389.02,561.5 h25
  text "R38" at 428.39,522.13 h25
  text "T37" at 389.02,482.76 h25
  text "U38" at 428.39,443.39 h25
  text "V37" at 389.02,404.02 h25
  text "W38" at 428.39,364.65 h25
  text "Y37" at 389.02,325.28 h25
  text "AA38" at 428.39,295.91 h25
  text "AB37" at 389.02,256.54 h25
  text "AC38" at 428.39,217.16 h25
  text "AD37" at 389.02,177.79 h25
  text "AE38" at 428.39,138.43 h25
  text "AF37" at 389.02,99.06 h25
  text "AG38" at 428.39,59.69 h25
  text "AH37" at 389.02,20.32 h25
  text "AJ38" at 428.39,-19.05 h25
  text "AK37" at 389.02,-58.42 h25
  text "AL38" at 428.39,-97.8 h25
  text "AM37" at 389.02,-137.16 h25
  text "AN38" at 428.39,-176.53 h25
  text "AP37" at 389.02,-215.91 h25
  text "BA14" at -516.5,-491.5 h25
  text "BD15" at -477.13,-609.61 h25
  text "BG26" at -44.05,-727.72 h25
  text "BH23" at -162.16,-767.09 h25
  text "BK27" at -4.68,-845.83 h25
  text "R18" at -359.02,522.13 h25
  text "U18" at -359.02,443.39 h25
  text "P17" at -398.39,561.5 h25
  text "T17" at -398.39,482.76 h25
  text "AG18" at -359.02,59.69 h25
  text "AE18" at -359.02,138.43 h25
  text "W18" at -359.02,364.65 h25
  text "AA18" at -359.02,295.91 h25
  text "AC18" at -359.02,217.16 h25
  text "AD17" at -398.39,177.79 h25
  text "V17" at -398.39,404.02 h25
  text "Y17" at -398.39,325.28 h25
  text "AB17" at -398.39,256.54 h25
  text "AJ18" at -359.02,-19.05 h25
  text "AH17" at -398.39,20.32 h25
  text "AF17" at -398.39,99.06 h25
  text "AU22" at -201.53,-334.02 h25
  text "AU20" at -280.28,-334.02 h25
  text "AU18" at -359.02,-334.02 h25
  text "AV19" at -319.65,-373.39 h25
  text "AV17" at -398.39,-373.39 h25
  text "AT17" at -398.39,-294.65 h25
  text "AT19" at -319.65,-294.65 h25
  text "AR18" at -359.02,-255.28 h25
  text "AP17" at -398.39,-215.91 h25
  text "AN18" at -359.02,-176.53 h25
  text "AM17" at -398.39,-137.16 h25
  text "AL18" at -359.02,-97.8 h25
  text "AK17" at -398.39,-58.42 h25
  text "AV23" at -162.16,-373.39 h25
  text "AU24" at -122.8,-334.02 h25
  text "AV21" at -240.91,-373.39 h25
  text "AV29" at 74.06,-373.39 h25
  text "AV31" at 152.79,-373.39 h25
  text "AV33" at 231.53,-373.39 h25
  text "AU28" at 34.69,-334.02 h25
  text "AU30" at 113.42,-334.02 h25
  text "AU32" at 192.16,-334.02 h25
  text "AV35" at 310.28,-373.39 h25
  text "AV25" at -83.42,-373.39 h25
  text "AR38" at 428.39,-255.28 h25
  text "AT37" at 389.02,-294.65 h25
  text "AU38" at 428.39,-334.02 h25
  text "AV37" at 389.02,-373.39 h25
  text "AU36" at 349.65,-334.02 h25
  text "AU34" at 270.91,-334.02 h25
  text "AU26" at -44.05,-334.02 h25
  text "AV27" at -4.68,-373.39 h25
  text "AW10" at -673.98,-412.76 h25
  text "BG29" at 74.06,-727.72 h25
  text "AU7" at -792.09,-344.02 h25
  text "BK35" at 310.28,-845.83 h25
  text "AL10" at -673.98,-97.8 h25
  text "AU41" at 546.5,-334.02 h25
  text "BM33" at 231.53,-924.57 h25
  text "BP29" at 74.06,-1003.31 h25
  text "BH30" at 113.42,-767.09 h25
  text "BL31" at 152.79,-885.2 h25
  text "BP28" at 34.69,-1003.31 h25
  text "BK34" at 270.91,-845.83 h25
  text "BJ53" at 1018.94,-806.46 h25
  text "BK30" at 113.42,-845.83 h25
  text "BL30" at 113.42,-885.2 h25
  text "BP22" at -201.53,-1003.31 h25
  text "BK33" at 231.53,-845.83 h25
  text "BP23" at -162.16,-1003.31 h25
  text "BH35" at 310.28,-767.09 h25
  text "BP26" at -44.05,-1003.31 h25
  text "BL35" at 310.28,-885.2 h25
  text "BN26" at -44.05,-963.94 h25
  text "BP32" at 192.16,-1003.31 h25
  text "BJ33" at 231.53,-806.46 h25
  text "AE27" at -4.68,138.43 h25
  text "BJ29" at 74.06,-806.46 h25
  text "BN32" at 192.16,-963.94 h25
  text "BF27" at -4.68,-688.35 h25
  text "BL33" at 231.53,-885.2 h25
  text "BH32" at 192.16,-767.09 h25
  text "BG28" at 34.69,-727.72 h25
  text "BF31" at 152.79,-688.35 h25
  text "BF26" at -44.05,-688.35 h25
  text "BG34" at 270.91,-727.72 h25
  text "BN31" at 152.79,-963.94 h25
  text "BG27" at -4.68,-727.72 h25
  text "BM35" at 310.28,-924.57 h25
  text "BL32" at 192.16,-885.2 h25
  text "BF36" at 349.65,-688.35 h25
  text "BN29" at 74.06,-963.94 h25
  text "BM28" at 34.69,-924.57 h25
  text "BM34" at 270.91,-924.57 h25
  text "N41" at 546.5,600.87 h25
  text "BK31" at 152.79,-845.83 h25
  text "BP34" at 270.91,-1003.31 h25
  text "AU14" at -516.5,-334.02 h25
  text "BP31" at 152.79,-1003.31 h25
  text "BN30" at 113.42,-963.94 h25
  text "BF35" at 310.28,-688.35 h25
  text "BA5" at -870.83,-501.5 h25
  text "N14" at -516.5,600.87 h25
  text "BF51" at 940.2,-688.35 h25
  text "BF48" at 822.09,-688.35 h25
  text "AP4" at -910.2,-225.91 h25
  text "BG49" at 861.46,-727.72 h25
  text "AN2" at -988.94,-186.53 h25
  text "BE53" at 1018.94,-648.98 h25
  text "AW6" at -831.46,-422.76 h25
  text "AY3" at -949.57,-462.13 h25
  text "AV3" at -949.57,-383.39 h25
  text "BF52" at 979.57,-688.35 h25
  text "AT3" at -949.57,-304.65 h25
  text "BE51" at 940.2,-648.98 h25
  text "AU1" at -1028.31,-344.02 h25
  text "AV4" at -910.2,-383.39 h25
  text "BL48" at 822.09,-885.2 h25
  text "AW2" at -988.94,-422.76 h25
  text "BF16" at -437.76,-688.35 h25
  text "BG48" at 822.09,-727.72 h25
  text "AN6" at -831.46,-186.53 h25
  text "BG15" at -477.13,-727.72 h25
  text "BG52" at 979.57,-727.72 h25
  text "AB27" at -4.68,256.54 h25
  text "BJ52" at 979.57,-806.46 h25
  text "AP3" at -949.57,-225.91 h25
  text "BK53" at 1018.94,-845.83 h25
  text "AU2" at -988.94,-344.02 h25
  text "BF50" at 900.83,-688.35 h25
  text "AR2" at -988.94,-265.28 h25
  text "BG53" at 1018.94,-727.72 h25
  text "AW5" at -870.83,-422.76 h25
  text "AW1" at -1028.31,-422.76 h25
  text "AT4" at -910.2,-304.65 h25
  text "AN1" at -1028.31,-186.53 h25
  text "BK54" at 1058.31,-845.83 h25
  text "AN5" at -870.83,-186.53 h25
  text "BH50" at 900.83,-767.09 h25
  text "AL1" at -1028.31,-107.8 h25
  text "BG47" at 782.72,-727.72 h25
  text "AL2" at -988.94,-107.8 h25
  text "BH54" at 1058.31,-767.09 h25
  text "AM3" at -949.57,-147.16 h25
  text "BF53" at 1018.94,-688.35 h25
  text "AE41" at 546.5,138.43 h25
  text "AM4" at -910.2,-147.16 h25
  text "AR1" at -1028.31,-265.28 h25
  text "BJ54" at 1058.31,-806.46 h25
  text "BE49" at 861.46,-648.98 h25
  text "AY4" at -910.2,-462.13 h25
  text "BE50" at 900.83,-648.98 h25
  text "BG54" at 1058.31,-727.72 h25
  text "BG50" at 900.83,-727.72 h25
  text "BF47" at 782.72,-688.35 h25
  text "BE54" at 1058.31,-648.98 h25
  text "BD51" at 940.2,-609.61 h25
  text "BE20" at -280.28,-648.98 h25
  text "BE22" at -201.53,-648.98 h25
  text "BE24" at -122.8,-648.98 h25
  text "BE32" at 192.16,-648.98 h25
  text "BE34" at 270.91,-648.98 h25
  text "BE36" at 349.65,-648.98 h25
  text "AE14" at -516.5,138.43 h25
  text "AE28" at 34.69,138.43 h25
  text "BH24" at -122.8,-767.09 h25
  text "BG24" at -122.8,-727.72 h25
  text "BG25" at -83.42,-727.72 h25
  text "BF25" at -83.42,-688.35 h25
  text "AW15" at -477.13,-412.76 h25
  text "AY15" at -477.13,-452.13 h25
  text "AY14" at -516.5,-452.13 h25
  text "AY13" at -555.87,-452.13 h25
  text "BA11" at -634.61,-491.5 h25
  text "BC11" at -634.61,-570.24 h25
  text "BB9" at -713.35,-540.87 h25
  text "BA10" at -673.98,-491.5 h25
  text "BC6" at -831.46,-580.24 h25
  text "BA6" at -831.46,-501.5 h25
  text "BB8" at -752.72,-540.87 h25
  text "AL15" at -477.13,-97.8 h25
  text "BD14" at -516.5,-609.61 h25
  text "BA1" at -1028.31,-501.5 h25
  text "AL14" at -516.5,-97.8 h25
  text "BA2" at -988.94,-501.5 h25
  text "BD13" at -555.87,-609.61 h25
  text "BC2" at -988.94,-580.24 h25
  text "BC7" at -792.09,-580.24 h25
  text "BC15" at -477.13,-570.24 h25
  text "BC10" at -673.98,-570.24 h25
  text "BB4" at -910.2,-540.87 h25
  text "BB3" at -949.57,-540.87 h25
  text "BC1" at -1028.31,-580.24 h25
  text "J35" at 310.28,758.35 h25
  text "AR15" at -477.13,-255.28 h25
  text "AR14" at -516.5,-255.28 h25
  text "F43" at 625.24,876.46 h25
  text "BE15" at -477.13,-648.98 h25
  text "BE14" at -516.5,-648.98 h25
  text "BM43" at 625.24,-924.57 h25
  text "BE13" at -555.87,-648.98 h25
  text "BE44" at 664.61,-648.98 h25
  text "BP47" at 782.72,-1003.31 h25
  text "BJ46" at 743.35,-806.46 h25
  text "BG42" at 585.87,-727.72 h25
  text "BD41" at 546.5,-609.61 h25
  text "BK44" at 664.61,-845.83 h25
  text "BP44" at 664.61,-1003.31 h25
  text "BK41" at 546.5,-845.83 h25
  text "BN46" at 743.35,-963.94 h25
  text "BC42" at 585.87,-570.24 h25
  text "BF45" at 703.98,-688.35 h25
  text "BD42" at 585.87,-609.61 h25
  text "BN42" at 585.87,-963.94 h25
  text "BF46" at 743.35,-688.35 h25
  text "BN44" at 664.61,-963.94 h25
  text "BH46" at 743.35,-767.09 h25
  text "BH45" at 703.98,-767.09 h25
  text "BK43" at 625.24,-845.83 h25
  text "BM44" at 664.61,-924.57 h25
  text "BK46" at 743.35,-845.83 h25
  text "BL47" at 782.72,-885.2 h25
  text "AT8" at -752.72,-304.65 h25
  text "BG43" at 625.24,-727.72 h25
  text "BH52" at 979.57,-767.09 h25
  text "BE43" at 625.24,-648.98 h25
  text "AT9" at -713.35,-304.65 h25
  text "BH44" at 664.61,-767.09 h25
  text "AY8" at -752.72,-462.13 h25
  text "BJ41" at 546.5,-806.46 h25
  text "AN10" at -673.98,-176.53 h25
  text "BH49" at 861.46,-767.09 h25
  text "BJ44" at 664.61,-806.46 h25
  text "AY9" at -713.35,-462.13 h25
  text "BP49" at 861.46,-1003.31 h25
  text "BG45" at 703.98,-727.72 h25
  text "BN49" at 861.46,-963.94 h25
  text "BE45" at 703.98,-648.98 h25
  text "AV8" at -752.72,-383.39 h25
  text "BP48" at 822.09,-1003.31 h25
  text "BN47" at 782.72,-963.94 h25
  text "BL53" at 1018.94,-885.2 h25
  text "BF43" at 625.24,-688.35 h25
  text "AV9" at -713.35,-383.39 h25
  text "BL51" at 940.2,-885.2 h25
  text "BE46" at 743.35,-648.98 h25
  text "AL11" at -634.61,-97.8 h25
  text "BG44" at 664.61,-727.72 h25
  text "AR10" at -673.98,-255.28 h25
  text "BN50" at 900.83,-963.94 h25
  text "BL43" at 625.24,-885.2 h25
  text "BM50" at 900.83,-924.57 h25
  text "BH42" at 585.87,-767.09 h25
  text "AW11" at -634.61,-412.76 h25
  text "BM52" at 979.57,-924.57 h25
  text "BP43" at 625.24,-1003.31 h25
  text "AR6" at -831.46,-265.28 h25
  text "BN51" at 940.2,-963.94 h25
  text "BL42" at 585.87,-885.2 h25
  text "BJ43" at 625.24,-806.46 h25
  text "AP9" at -713.35,-225.91 h25
  text "BF41" at 546.5,-688.35 h25
  text "BL45" at 703.98,-885.2 h25
  text "AP8" at -752.72,-225.91 h25
  text "BM48" at 822.09,-924.57 h25
  text "BK45" at 703.98,-845.83 h25
  text "AM8" at -752.72,-147.16 h25
  text "BM49" at 861.46,-924.57 h25
  text "BN45" at 703.98,-963.94 h25
  text "AU11" at -634.61,-334.02 h25
  text "BL52" at 979.57,-885.2 h25
  text "BM45" at 703.98,-924.57 h25
  text "BP46" at 743.35,-1003.31 h25
  text "BJ42" at 585.87,-806.46 h25
  text "BF42" at 585.87,-688.35 h25
  text "AR11" at -634.61,-255.28 h25
  text "BL46" at 743.35,-885.2 h25
  text "AU10" at -673.98,-334.02 h25
  text "BM30" at 113.42,-924.57 h25
  text "BH34" at 270.91,-767.09 h25
  text "AR7" at -792.09,-265.28 h25
  text "BJ34" at 270.91,-806.46 h25
  text "AU6" at -831.46,-344.02 h25
  text "BN34" at 270.91,-963.94 h25
  text "AM9" at -713.35,-147.16 h25
  text "AN11" at -634.61,-176.53 h25
  text "BG35" at 310.28,-727.72 h25
  text "BF13" at -555.87,-688.35 h25
  text "J24" at -122.8,758.35 h25
  text "A38" at 428.39,1073.31 h25
  text "M23" at -162.16,640.24 h25
  text "BA44" at 664.61,-491.5 h25
  text "BM9" at -713.35,-934.57 h25
  text "B38" at 428.39,1033.94 h25
  text "BA50" at 900.83,-491.5 h25
  text "F25" at -83.42,876.46 h25
  text "BK9" at -713.35,-855.83 h25
  text "J34" at 270.91,758.35 h25
  text "D22" at -201.53,955.2 h25
  text "D9" at -713.35,945.2 h25
  text "D14" at -516.5,955.2 h25
  text "BL10" at -673.98,-885.2 h25
  text "K34" at 270.91,718.98 h25
  text "E17" at -398.39,915.83 h25
  text "A23" at -162.16,1073.31 h25
  text "BK10" at -673.98,-845.83 h25
  text "K37" at 389.02,718.98 h25
  text "AW54" at 1058.31,-412.76 h25
  text "AU45" at 703.98,-334.02 h25
  text "BL8" at -752.72,-895.2 h25
  text "C38" at 428.39,994.57 h25
  text "AW50" at 900.83,-412.76 h25
  text "BM24" at -122.8,-924.57 h25
  text "E21" at -240.91,915.83 h25
  text "BL2" at -988.94,-895.2 h25
  text "BN10" at -673.98,-963.94 h25
  text "BN25" at -83.42,-963.94 h25
  text "E36" at 349.65,915.83 h25
  text "AW49" at 861.46,-412.76 h25
  text "BL3" at -949.57,-895.2 h25
  text "BM25" at -83.42,-924.57 h25
  text "AV47" at 782.72,-373.39 h25
  text "BM10" at -673.98,-924.57 h25
  text "BP24" at -122.8,-1003.31 h25
  text "B35" at 310.28,1033.94 h25
  text "B22" at -201.53,1033.94 h25
  text "BN24" at -122.8,-963.94 h25
  text "BN9" at -713.35,-973.94 h25
  text "L35" at 310.28,679.61 h25
  text "AY47" at 782.72,-452.13 h25
  text "L16" at -437.76,679.61 h25
  text "D21" at -240.91,955.2 h25
  text "BJ9" at -713.35,-816.46 h25
  text "D34" at 270.91,955.2 h25
  text "AT46" at 743.35,-294.65 h25
  text "AK46" at 743.35,-58.42 h25
  text "AW53" at 1018.94,-412.76 h25
  text "J17" at -398.39,758.35 h25
  text "BL12" at -595.24,-885.2 h25
  text "E39" at 467.76,915.83 h25
  text "AK47" at 782.72,-58.42 h25
  text "AY46" at 743.35,-452.13 h25
  text "AL49" at 861.46,-97.8 h25
  text "A25" at -83.42,1073.31 h25
  text "BP12" at -595.24,-1003.31 h25
  text "BJ13" at -555.87,-806.46 h25
  text "A35" at 310.28,1073.31 h25
  text "AL50" at 900.83,-97.8 h25
  text "BB52" at 979.57,-530.87 h25
  text "AJ48" at 822.09,-19.05 h25
  text "E18" at -359.02,915.83 h25
  text "F17" at -398.39,876.46 h25
  text "F27" at -4.68,876.46 h25
  text "G24" at -122.8,837.09 h25
  text "H21" at -240.91,797.72 h25
  text "J18" at -359.02,758.35 h25
  text "K25" at -83.42,718.98 h25
  text "BJ3" at -949.57,-816.46 h25
  text "BJ12" at -595.24,-806.46 h25
  text "C35" at 310.28,994.57 h25
  text "AJ49" at 861.46,-19.05 h25
  text "BC45" at 703.98,-570.24 h25
  text "AK51" at 940.2,-58.42 h25
  text "BK15" at -477.13,-845.83 h25
  text "E37" at 389.02,915.83 h25
  text "AK52" at 979.57,-58.42 h25
  text "AW45" at 703.98,-412.76 h25
  text "BP11" at -634.61,-1003.31 h25
  text "AJ44" at 664.61,-19.05 h25
  text "D26" at -44.05,955.2 h25
  text "BL13" at -555.87,-885.2 h25
  text "E38" at 428.39,915.83 h25
  text "AJ45" at 703.98,-19.05 h25
  text "BL50" at 900.83,-885.2 h25
  text "AJ53" at 1018.94,-19.05 h25
  text "H27" at -4.68,797.72 h25
  text "BH14" at -516.5,-767.09 h25
  text "C37" at 389.02,994.57 h25
  text "AJ54" at 1058.31,-19.05 h25
  text "BH10" at -673.98,-767.09 h25
  text "V51" at 940.2,404.02 h25
  text "U53" at 1018.94,443.39 h25
  text "AH46" at 743.35,20.32 h25
  text "BH15" at -477.13,-767.09 h25
  text "AA53" at 1018.94,295.91 h25
  text "U54" at 1058.31,443.39 h25
  text "J41" at 546.5,758.35 h25
  text "B36" at 349.65,1033.94 h25
  text "AH47" at 782.72,20.32 h25
  text "AT51" at 940.2,-294.65 h25
  text "BJ2" at -988.94,-816.46 h25
  text "BH9" at -713.35,-777.09 h25
  text "U49" at 861.46,443.39 h25
  text "AH51" at 940.2,20.32 h25
  text "AV52" at 979.57,-373.39 h25
  text "K14" at -516.5,718.98 h25
  text "BK14" at -516.5,-845.83 h25
  text "AA44" at 664.61,295.91 h25
  text "U50" at 900.83,443.39 h25
  text "F34" at 270.91,876.46 h25
  text "AH52" at 979.57,20.32 h25
  text "K13" at -555.87,718.98 h25
  text "T51" at 940.2,482.76 h25
  text "BA53" at 1018.94,-491.5 h25
  text "C10" at -673.98,994.57 h25
  text "BJ14" at -516.5,-806.46 h25
  text "W44" at 664.61,364.65 h25
  text "T52" at 979.57,482.76 h25
  text "J37" at 389.02,758.35 h25
  text "C23" at -162.16,994.57 h25
  text "C9" at -713.35,984.57 h25
  text "W48" at 822.09,364.65 h25
  text "R53" at 1018.94,522.13 h25
  text "F18" at -359.02,876.46 h25
  text "BE9" at -713.35,-658.98 h25
  text "V52" at 979.57,404.02 h25
  text "R54" at 1058.31,522.13 h25
  text "C39" at 467.76,994.57 h25
  text "AY51" at 940.2,-452.13 h25
  text "W54" at 1058.31,364.65 h25
  text "V46" at 743.35,404.02 h25
  text "D17" at -398.39,955.2 h25
  text "BE10" at -673.98,-648.98 h25
  text "V47" at 782.72,404.02 h25
  text "C34" at 270.91,994.57 h25
  text "B21" at -240.91,1033.94 h25
  text "W53" at 1018.94,364.65 h25
  text "U44" at 664.61,443.39 h25
  text "B20" at -280.28,1033.94 h25
  text "BA54" at 1058.31,-491.5 h25
  text "BG13" at -555.87,-727.72 h25
  text "U45" at 703.98,443.39 h25
  text "B37" at 389.02,1033.94 h25
  text "D16" at -437.76,955.2 h25
  text "E26" at -44.05,915.83 h25
  text "T46" at 743.35,482.76 h25
  text "A24" at -122.8,1073.31 h25
  text "BE11" at -634.61,-648.98 h25
  text "T47" at 782.72,482.76 h25
  text "A36" at 349.65,1073.31 h25
  text "BC54" at 1058.31,-570.24 h25
  text "R44" at 664.61,522.13 h25
  text "BC44" at 664.61,-570.24 h25
  text "BP9" at -713.35,-1013.31 h25
  text "BG12" at -595.24,-727.72 h25
  text "Y52" at 979.57,325.28 h25
  text "R45" at 703.98,522.13 h25
  text "D36" at 349.65,955.2 h25
  text "BB46" at 743.35,-530.87 h25
  text "BP8" at -752.72,-1013.31 h25
  text "AA54" at 1058.31,295.91 h25
  text "BJ11" at -634.61,-806.46 h25
  text "BG9" at -713.35,-737.72 h25
  text "Y46" at 743.35,325.28 h25
  text "D37" at 389.02,955.2 h25
  text "BB47" at 782.72,-530.87 h25
  text "BK11" at -634.61,-845.83 h25
  text "AU53" at 1018.94,-334.02 h25
  text "BJ1" at -1028.31,-816.46 h25
  text "BG10" at -673.98,-727.72 h25
  text "AU54" at 1058.31,-334.02 h25
  text "BH5" at -870.83,-777.09 h25
  text "W49" at 861.46,364.65 h25
  text "BB51" at 940.2,-530.87 h25
  text "BH4" at -910.2,-777.09 h25
  text "BF10" at -673.98,-688.35 h25
  text "Y51" at 940.2,325.28 h25
  text "BH2" at -988.94,-777.09 h25
  text "BK1" at -1028.31,-855.83 h25
  text "H10" at -673.98,797.72 h25
  text "BF12" at -595.24,-688.35 h25
  text "AY52" at 979.57,-452.13 h25
  text "G10" at -673.98,837.09 h25
  text "E34" at 270.91,915.83 h25
  text "AG48" at 822.09,59.69 h25
  text "BC53" at 1018.94,-570.24 h25
  text "E13" at -555.87,915.83 h25
  text "J12" at -595.24,758.35 h25
  text "G37" at 389.02,837.09 h25
  text "AG49" at 861.46,59.69 h25
  text "BA49" at 861.46,-491.5 h25
  text "D12" at -595.24,955.2 h25
  text "AA45" at 703.98,295.91 h25
  text "F38" at 428.39,876.46 h25
  text "AG53" at 1018.94,59.69 h25
  text "BA45" at 703.98,-491.5 h25
  text "H14" at -516.5,797.72 h25
  text "D35" at 310.28,955.2 h25
  text "AG54" at 1058.31,59.69 h25
  text "BC49" at 861.46,-570.24 h25
  text "A34" at 270.91,1073.31 h25
  text "AG44" at 664.61,59.69 h25
  text "E22" at -201.53,915.83 h25
  text "G13" at -555.87,837.09 h25
  text "W45" at 703.98,364.65 h25
  text "AG45" at 703.98,59.69 h25
  text "AW44" at 664.61,-412.76 h25
  text "Y47" at 782.72,325.28 h25
  text "AF51" at 940.2,99.06 h25
  text "AU44" at 664.61,-334.02 h25
  text "J11" at -634.61,758.35 h25
  text "BN27" at -4.68,-963.94 h25
  text "AF52" at 979.57,99.06 h25
  text "BG23" at -162.16,-727.72 h25
  text "AF46" at 743.35,99.06 h25
  text "F23" at -162.16,876.46 h25
  text "F26" at -44.05,876.46 h25
  text "H13" at -555.87,797.72 h25
  text "AF47" at 782.72,99.06 h25
  text "AT52" at 979.57,-294.65 h25
  text "AE53" at 1018.94,138.43 h25
  text "F21" at -240.91,876.46 h25
  text "E19" at -319.65,915.83 h25
  text "J15" at -477.13,758.35 h25
  text "AE54" at 1058.31,138.43 h25
  text "J20" at -280.28,758.35 h25
  text "AV46" at 743.35,-373.39 h25
  text "AE44" at 664.61,138.43 h25
  text "B25" at -83.42,1033.94 h25
  text "AV51" at 940.2,-373.39 h25
  text "J14" at -516.5,758.35 h25
  text "AE45" at 703.98,138.43 h25
  text "A18" at -359.02,1073.31 h25
  text "G27" at -4.68,837.09 h25
  text "G41" at 546.5,837.09 h25
  text "AE49" at 861.46,138.43 h25
  text "B23" at -162.16,1033.94 h25
  text "H15" at -477.13,797.72 h25
  text "AE50" at 900.83,138.43 h25
  text "B18" at -359.02,1033.94 h25
  text "AU48" at 822.09,-334.02 h25
  text "H43" at 625.24,797.72 h25
  text "C24" at -122.8,994.57 h25
  text "AT47" at 782.72,-294.65 h25
  text "H12" at -595.24,797.72 h25
  text "C25" at -83.42,994.57 h25
  text "BC48" at 822.09,-570.24 h25
  text "H40" at 507.13,797.72 h25
  text "F24" at -122.8,876.46 h25
  text "AU49" at 861.46,-334.02 h25
  text "D11" at -634.61,955.2 h25
  text "BN22" at -201.53,-963.94 h25
  text "BM3" at -949.57,-934.57 h25
  text "J40" at 507.13,758.35 h25
  text "G20" at -280.28,837.09 h25
  text "F9" at -713.35,866.46 h25
  text "BM22" at -201.53,-924.57 h25
  text "B17" at -398.39,1033.94 h25
  text "G42" at 585.87,837.09 h25
  text "C17" at -398.39,994.57 h25
  text "G11" at -634.61,837.09 h25
  text "BK6" at -831.46,-855.83 h25
  text "C18" at -359.02,994.57 h25
  text "G40" at 507.13,837.09 h25
  text "L23" at -162.16,679.61 h25
  text "E12" at -595.24,915.83 h25
  text "BH47" at 782.72,-767.09 h25
  text "BM4" at -910.2,-934.57 h25
  text "B26" at -44.05,1033.94 h25
  text "J42" at 585.87,758.35 h25
  text "D10" at -673.98,955.2 h25
  text "J25" at -83.42,758.35 h25
  text "H42" at 585.87,797.72 h25
  text "A19" at -319.65,1073.31 h25
  text "E11" at -634.61,915.83 h25
  text "AB42" at 585.87,256.54 h25
  text "K22" at -201.53,718.98 h25
  text "AB43" at 625.24,256.54 h25
  text "F45" at 703.98,876.46 h25
  text "J19" at -319.65,758.35 h25
  text "E9" at -713.35,905.83 h25
  text "Y42" at 585.87,325.28 h25
  text "G21" at -240.91,837.09 h25
  text "Y43" at 625.24,325.28 h25
  text "BH51" at 940.2,-767.09 h25
  text "F46" at 743.35,876.46 h25
  text "J27" at -4.68,758.35 h25
  text "F10" at -673.98,876.46 h25
  text "T42" at 585.87,482.76 h25
  text "K27" at -4.68,718.98 h25
  text "T43" at 625.24,482.76 h25
  text "BJ51" at 940.2,-806.46 h25
  text "F44" at 664.61,876.46 h25
  text "H20" at -280.28,797.72 h25
  text "F11" at -634.61,876.46 h25
  text "P42" at 585.87,561.5 h25
  text "J26" at -44.05,758.35 h25
  text "P43" at 625.24,561.5 h25
  text "BH11" at -634.61,-767.09 h25
  text "G45" at 703.98,837.09 h25
  text "F13" at -555.87,876.46 h25
  text "BJ4" at -910.2,-816.46 h25
  text "BK3" at -949.57,-855.83 h25
  text "H45" at 703.98,797.72 h25
  text "F14" at -516.5,876.46 h25
  text "F35" at 310.28,876.46 h25
  text "D46" at 743.35,955.2 h25
  text "F15" at -477.13,876.46 h25
  text "F36" at 349.65,876.46 h25
  text "E44" at 664.61,915.83 h25
  text "E14" at -516.5,915.83 h25
  text "M17" at -398.39,640.24 h25
  text "M19" at -319.65,640.24 h25
  text "M21" at -240.91,640.24 h25
  text "M25" at -83.42,640.24 h25
  text "M27" at -4.68,640.24 h25
  text "M29" at 74.06,640.24 h25
  text "M31" at 152.79,640.24 h25
  text "M33" at 231.53,640.24 h25
  text "M37" at 389.02,640.24 h25
  text "N18" at -359.02,600.87 h25
  text "N20" at -280.28,600.87 h25
  text "N22" at -201.53,600.87 h25
  text "N24" at -122.8,600.87 h25
  text "N26" at -44.05,600.87 h25
  text "N28" at 34.69,600.87 h25
  text "N30" at 113.42,600.87 h25
  text "N32" at 192.16,600.87 h25
  text "N34" at 270.91,600.87 h25
  text "N36" at 349.65,600.87 h25
  text "N38" at 428.39,600.87 h25
  text "P19" at -319.65,561.5 h25
  text "P21" at -240.91,561.5 h25
  text "P23" at -162.16,561.5 h25
  text "P25" at -83.42,561.5 h25
  text "P27" at -4.68,561.5 h25
  text "P29" at 74.06,561.5 h25
  text "P31" at 152.79,561.5 h25
  text "P33" at 231.53,561.5 h25
  text "P35" at 310.28,561.5 h25
  text "R20" at -280.28,522.13 h25
  text "R22" at -201.53,522.13 h25
  text "R24" at -122.8,522.13 h25
  text "R26" at -44.05,522.13 h25
  text "R28" at 34.69,522.13 h25
  text "R30" at 113.42,522.13 h25
  text "R32" at 192.16,522.13 h25
  text "R34" at 270.91,522.13 h25
  text "R36" at 349.65,522.13 h25
  text "T19" at -319.65,482.76 h25
  text "T21" at -240.91,482.76 h25
  text "T23" at -162.16,482.76 h25
  text "T25" at -83.42,482.76 h25
  text "T27" at -4.68,482.76 h25
  text "T29" at 74.06,482.76 h25
  text "T31" at 152.79,482.76 h25
  text "T33" at 231.53,482.76 h25
  text "T35" at 310.28,482.76 h25
  text "U20" at -280.28,443.39 h25
  text "U22" at -201.53,443.39 h25
  text "U24" at -122.8,443.39 h25
  text "U26" at -44.05,443.39 h25
  text "U28" at 34.69,443.39 h25
  text "U30" at 113.42,443.39 h25
  text "U32" at 192.16,443.39 h25
  text "U34" at 270.91,443.39 h25
  text "U36" at 349.65,443.39 h25
  text "V19" at -319.65,404.02 h25
  text "V21" at -240.91,404.02 h25
  text "V23" at -162.16,404.02 h25
  text "V25" at -83.42,404.02 h25
  text "V27" at -4.68,404.02 h25
  text "V29" at 74.06,404.02 h25
  text "V31" at 152.79,404.02 h25
  text "V33" at 231.53,404.02 h25
  text "V35" at 310.28,404.02 h25
  text "W20" at -280.28,364.65 h25
  text "W22" at -201.53,364.65 h25
  text "W24" at -122.8,364.65 h25
  text "W26" at -44.05,364.65 h25
  text "W28" at 34.69,364.65 h25
  text "W30" at 113.42,364.65 h25
  text "W32" at 192.16,364.65 h25
  text "W34" at 270.91,364.65 h25
  text "W36" at 349.65,364.65 h25
  text "Y19" at -319.65,325.28 h25
  text "Y21" at -240.91,325.28 h25
  text "Y23" at -162.16,325.28 h25
  text "Y25" at -83.42,325.28 h25
  text "Y27" at -4.68,325.28 h25
  text "Y29" at 74.06,325.28 h25
  text "Y31" at 152.79,325.28 h25
  text "Y33" at 231.53,325.28 h25
  text "Y35" at 310.28,325.28 h25
  text "AA20" at -280.28,295.91 h25
  text "AA22" at -201.53,295.91 h25
  text "AA24" at -122.8,295.91 h25
  text "AA26" at -44.05,295.91 h25
  text "AA28" at 34.69,295.91 h25
  text "AA30" at 113.42,295.91 h25
  text "AA32" at 192.16,295.91 h25
  text "AA34" at 270.91,295.91 h25
  text "AA36" at 349.65,295.91 h25
  text "AB19" at -319.65,256.54 h25
  text "AB21" at -240.91,256.54 h25
  text "AB23" at -162.16,256.54 h25
  text "AB25" at -83.42,256.54 h25
  text "AB29" at 74.06,256.54 h25
  text "AB31" at 152.79,256.54 h25
  text "AB33" at 231.53,256.54 h25
  text "AB35" at 310.28,256.54 h25
  text "AC20" at -280.28,217.16 h25
  text "AC22" at -201.53,217.16 h25
  text "AC24" at -122.8,217.16 h25
  text "AC26" at -44.05,217.16 h25
  text "AC30" at 113.42,217.16 h25
  text "AC32" at 192.16,217.16 h25
  text "AC34" at 270.91,217.16 h25
  text "AC36" at 349.65,217.16 h25
  text "AD19" at -319.65,177.79 h25
  text "AD21" at -240.91,177.79 h25
  text "AD23" at -162.16,177.79 h25
  text "AD25" at -83.42,177.79 h25
  text "AD29" at 74.06,177.79 h25
  text "AD31" at 152.79,177.79 h25
  text "AD33" at 231.53,177.79 h25
  text "AD35" at 310.28,177.79 h25
  text "AE20" at -280.28,138.43 h25
  text "AE22" at -201.53,138.43 h25
  text "AE24" at -122.8,138.43 h25
  text "AE26" at -44.05,138.43 h25
  text "AE30" at 113.42,138.43 h25
  text "AE32" at 192.16,138.43 h25
  text "AE34" at 270.91,138.43 h25
  text "AE36" at 349.65,138.43 h25
  text "AF19" at -319.65,99.06 h25
  text "AF21" at -240.91,99.06 h25
  text "AF23" at -162.16,99.06 h25
  text "AF25" at -83.42,99.06 h25
  text "AF27" at -4.68,99.06 h25
  text "AF29" at 74.06,99.06 h25
  text "AF31" at 152.79,99.06 h25
  text "AF33" at 231.53,99.06 h25
  text "AF35" at 310.28,99.06 h25
  text "AG20" at -280.28,59.69 h25
  text "AG22" at -201.53,59.69 h25
  text "AG24" at -122.8,59.69 h25
  text "AG26" at -44.05,59.69 h25
  text "AG28" at 34.69,59.69 h25
  text "AG30" at 113.42,59.69 h25
  text "AG32" at 192.16,59.69 h25
  text "AG34" at 270.91,59.69 h25
  text "AG36" at 349.65,59.69 h25
  text "AH19" at -319.65,20.32 h25
  text "AH21" at -240.91,20.32 h25
  text "AH23" at -162.16,20.32 h25
  text "AH25" at -83.42,20.32 h25
  text "AH27" at -4.68,20.32 h25
  text "AH29" at 74.06,20.32 h25
  text "AH31" at 152.79,20.32 h25
  text "AH33" at 231.53,20.32 h25
  text "AH35" at 310.28,20.32 h25
  text "AJ20" at -280.28,-19.05 h25
  text "AJ22" at -201.53,-19.05 h25
  text "AJ24" at -122.8,-19.05 h25
  text "AJ26" at -44.05,-19.05 h25
  text "AJ28" at 34.69,-19.05 h25
  text "AJ30" at 113.42,-19.05 h25
  text "AJ32" at 192.16,-19.05 h25
  text "AJ34" at 270.91,-19.05 h25
  text "AJ36" at 349.65,-19.05 h25
  text "AK19" at -319.65,-58.42 h25
  text "AK21" at -240.91,-58.42 h25
  text "AK23" at -162.16,-58.42 h25
  text "AK25" at -83.42,-58.42 h25
  text "AK27" at -4.68,-58.42 h25
  text "AK29" at 74.06,-58.42 h25
  text "AK31" at 152.79,-58.42 h25
  text "AK33" at 231.53,-58.42 h25
  text "AK35" at 310.28,-58.42 h25
  text "AL20" at -280.28,-97.8 h25
  text "AL22" at -201.53,-97.8 h25
  text "AL24" at -122.8,-97.8 h25
  text "AL26" at -44.05,-97.8 h25
  text "AL28" at 34.69,-97.8 h25
  text "AL30" at 113.42,-97.8 h25
  text "AL32" at 192.16,-97.8 h25
  text "AL34" at 270.91,-97.8 h25
  text "AL36" at 349.65,-97.8 h25
  text "AM19" at -319.65,-137.16 h25
  text "AM21" at -240.91,-137.16 h25
  text "AM23" at -162.16,-137.16 h25
  text "AM25" at -83.42,-137.16 h25
  text "AM27" at -4.68,-137.16 h25
  text "AM29" at 74.06,-137.16 h25
  text "AM31" at 152.79,-137.16 h25
  text "AM33" at 231.53,-137.16 h25
  text "AM35" at 310.28,-137.16 h25
  text "AN20" at -280.28,-176.53 h25
  text "AN22" at -201.53,-176.53 h25
  text "AN24" at -122.8,-176.53 h25
  text "AN26" at -44.05,-176.53 h25
  text "AN28" at 34.69,-176.53 h25
  text "AN30" at 113.42,-176.53 h25
  text "AN32" at 192.16,-176.53 h25
  text "AN34" at 270.91,-176.53 h25
  text "AN36" at 349.65,-176.53 h25
  text "AP19" at -319.65,-215.91 h25
  text "AP21" at -240.91,-215.91 h25
  text "AP23" at -162.16,-215.91 h25
  text "AP25" at -83.42,-215.91 h25
  text "AP27" at -4.68,-215.91 h25
  text "AP29" at 74.06,-215.91 h25
  text "AP31" at 152.79,-215.91 h25
  text "AP33" at 231.53,-215.91 h25
  text "AP35" at 310.28,-215.91 h25
  text "AR20" at -280.28,-255.28 h25
  text "AR22" at -201.53,-255.28 h25
  text "AR24" at -122.8,-255.28 h25
  text "AR26" at -44.05,-255.28 h25
  text "AR28" at 34.69,-255.28 h25
  text "AR30" at 113.42,-255.28 h25
  text "AR32" at 192.16,-255.28 h25
  text "AR34" at 270.91,-255.28 h25
  text "AR36" at 349.65,-255.28 h25
  text "AT21" at -240.91,-294.65 h25
  text "AT23" at -162.16,-294.65 h25
  text "AT25" at -83.42,-294.65 h25
  text "AT27" at -4.68,-294.65 h25
  text "AT29" at 74.06,-294.65 h25
  text "AT31" at 152.79,-294.65 h25
  text "AT33" at 231.53,-294.65 h25
  text "AT35" at 310.28,-294.65 h25
  text "E46" at 743.35,915.83 h25
  text "BL34" at 270.91,-885.2 h25
  text "BG41" at 546.5,-727.72 h25
  text "BG51" at 940.2,-727.72 h25
  text "BH33" at 231.53,-767.09 h25
  text "BH48" at 822.09,-767.09 h25
  text "BJ30" at 113.42,-806.46 h25
  text "BJ45" at 703.98,-806.46 h25
  text "BK42" at 585.87,-845.83 h25
  text "BL49" at 861.46,-885.2 h25
  text "A15" at -477.13,1073.31 h25
  text "BJ47" at 782.72,-806.46 h25
  text "D44" at 664.61,955.2 h25
  text "D15" at -477.13,955.2 h25
  text "C43" at 625.24,994.57 h25
  text "B15" at -477.13,1033.94 h25
  text "C45" at 703.98,994.57 h25
  text "A14" at -516.5,1073.31 h25
  text "A45" at 703.98,1073.31 h25
  text "C15" at -477.13,994.57 h25
  text "BK23" at -162.16,-845.83 h25
  text "BK24" at -122.8,-845.83 h25
  text "B46" at 743.35,1033.94 h25
  text "B11" at -634.61,1033.94 h25
  text "BL22" at -201.53,-885.2 h25
  text "BH21" at -240.91,-767.09 h25
  text "C44" at 664.61,994.57 h25
  text "B10" at -673.98,1033.94 h25
  text "BF23" at -162.16,-688.35 h25
  text "A46" at 743.35,1073.31 h25
  text "A10" at -673.98,1073.31 h25
  text "A43" at 625.24,1073.31 h25
  text "C12" at -595.24,994.57 h25
  text "B45" at 703.98,1033.94 h25
  text "A8" at -752.72,1063.31 h25
  text "BH1" at -1028.31,-777.09 h25
  text "D42" at 585.87,955.2 h25
  text "A9" at -713.35,1063.31 h25
  text "R41" at 546.5,522.13 h25
  text "H52" at 979.57,797.72 h25
  text "C40" at 507.13,994.57 h25
  text "B12" at -595.24,1033.94 h25
  text "R40" at 507.13,522.13 h25
  text "L45" at 703.98,679.61 h25
  text "W41" at 546.5,364.65 h25
  text "D40" at 507.13,955.2 h25
  text "B13" at -555.87,1033.94 h25
  text "W40" at 507.13,364.65 h25
  text "J53" at 1018.94,758.35 h25
  text "A39" at 467.76,1073.31 h25
  text "A11" at -634.61,1073.31 h25
  text "B40" at 507.13,1033.94 h25
  text "K35" at 310.28,718.98 h25
  text "E30" at 113.42,915.83 h25
  text "E40" at 507.13,915.83 h25
  text "G34" at 270.91,837.09 h25
  text "G44" at 664.61,837.09 h25
  text "H31" at 152.79,797.72 h25
  text "H41" at 546.5,797.72 h25
  text "J28" at 34.69,758.35 h25
  text "J38" at 428.39,758.35 h25
  text "K46" at 743.35,718.98 h25
  text "A41" at 546.5,1073.31 h25
  text "L54" at 1058.31,679.61 h25
  text "BH26" at -44.05,-767.09 h25
  text "L44" at 664.61,679.61 h25
  text "D41" at 546.5,955.2 h25
  text "B41" at 546.5,1033.94 h25
  text "BH25" at -83.42,-767.09 h25
  text "B42" at 585.87,1033.94 h25
  text "BJ26" at -44.05,-806.46 h25
  text "L53" at 1018.94,679.61 h25
  text "BK25" at -83.42,-845.83 h25
  text "K47" at 782.72,718.98 h25
  text "E41" at 546.5,915.83 h25
  text "H51" at 940.2,797.72 h25
  text "J49" at 861.46,758.35 h25
  text "J48" at 822.09,758.35 h25
  text "H38" at 428.39,797.72 h25
  text "K51" at 940.2,718.98 h25
  text "H37" at 389.02,797.72 h25
  text "L48" at 822.09,679.61 h25
  text "J54" at 1058.31,758.35 h25
  text "L49" at 861.46,679.61 h25
  text "BL5" at -870.83,-895.2 h25
  text "BP27" at -4.68,-1003.31 h25
  text "K52" at 979.57,718.98 h25
  text "H34" at 270.91,797.72 h25
  text "AJ41" at 546.5,-19.05 h25
  text "H35" at 310.28,797.72 h25
  text "AJ40" at 507.13,-19.05 h25
  text "L33" at 231.53,679.61 h25
  text "G38" at 428.39,837.09 h25
  text "K33" at 231.53,718.98 h25
  text "D52" at 979.57,955.2 h25
  text "F39" at 467.76,876.46 h25
  text "H33" at 231.53,797.72 h25
  text "A49" at 861.46,1073.31 h25
  text "G35" at 310.28,837.09 h25
  text "G33" at 231.53,837.09 h25
  text "BK28" at 34.69,-845.83 h25
  text "G48" at 822.09,837.09 h25
  text "G36" at 349.65,837.09 h25
  text "E31" at 152.79,915.83 h25
  text "BJ28" at 34.69,-806.46 h25
  text "F52" at 979.57,876.46 h25
  text "K41" at 546.5,718.98 h25
  text "E32" at 192.16,915.83 h25
  text "BL26" at -44.05,-885.2 h25
  text "C48" at 822.09,994.57 h25
  text "K42" at 585.87,718.98 h25
  text "C30" at 113.42,994.57 h25
  text "BL27" at -4.68,-885.2 h25
  text "J44" at 664.61,758.35 h25
  text "B31" at 152.79,1033.94 h25
  text "H44" at 664.61,797.72 h25
  text "F30" at 113.42,876.46 h25
  text "E54" at 1058.31,915.83 h25
  text "AG40" at 507.13,59.69 h25
  text "E42" at 585.87,915.83 h25
  text "E28" at 34.69,915.83 h25
  text "E48" at 822.09,915.83 h25
  text "AG41" at 546.5,59.69 h25
  text "E43" at 625.24,915.83 h25
  text "E49" at 861.46,915.83 h25
  text "F40" at 507.13,876.46 h25
  text "G54" at 1058.31,837.09 h25
  text "F41" at 546.5,876.46 h25
  text "F51" at 940.2,876.46 h25
  text "D45" at 703.98,955.2 h25
  text "E53" at 1018.94,915.83 h25
  text "A44" at 664.61,1073.31 h25
  text "D51" at 940.2,955.2 h25
  text "BP42" at 585.87,-1003.31 h25
  text "BL7" at -792.09,-895.2 h25
  text "G49" at 861.46,837.09 h25
  text "BM7" at -792.09,-934.57 h25
  text "J32" at 192.16,758.35 h25
  text "BL6" at -831.46,-895.2 h25
  text "G53" at 1018.94,837.09 h25
  text "BN4" at -910.2,-973.94 h25
  text "A50" at 900.83,1073.31 h25
  text "K32" at 192.16,718.98 h25
  text "BM5" at -870.83,-934.57 h25
  text "C49" at 861.46,994.57 h25
  text "BE41" at 546.5,-648.98 h25
  text "AV42" at 585.87,-373.39 h25
  text "L29" at 74.06,679.61 h25
  text "BF11" at -634.61,-688.35 h25
  text "AV43" at 625.24,-373.39 h25
  text "BN14" at -516.5,-963.94 h25
  text "L30" at 113.42,679.61 h25
  text "E24" at -122.8,915.83 h25
  text "L31" at 152.79,679.61 h25
  text "B16" at -437.76,1033.94 h25
  text "G17" at -398.39,837.09 h25
  text "K31" at 152.79,718.98 h25
  text "J22" at -201.53,758.35 h25
  text "G18" at -359.02,837.09 h25
  text "J30" at 113.42,758.35 h25
  text "J21" at -240.91,758.35 h25
  text "G43" at 625.24,837.09 h25
  text "E27" at -4.68,915.83 h25
  text "A40" at 507.13,1073.31 h25
  text "K29" at 74.06,718.98 h25
  text "G16" at -437.76,837.09 h25
  text "H19" at -319.65,797.72 h25
  text "BM32" at 192.16,-924.57 h25
  text "J31" at 152.79,758.35 h25
  text "A20" at -280.28,1073.31 h25
  text "H29" at 74.06,797.72 h25
  text "H22" at -201.53,797.72 h25
  text "G14" at -516.5,837.09 h25
  text "H11" at -634.61,797.72 h25
  text "K15" at -477.13,718.98 h25
  text "BG6" at -831.46,-737.72 h25
  text "BH3" at -949.57,-777.09 h25
  text "BH13" at -555.87,-767.09 h25
  text "BJ10" at -673.98,-806.46 h25
  text "BK7" at -792.09,-855.83 h25
  text "BL14" at -516.5,-885.2 h25
  text "K23" at -162.16,718.98 h25
  text "AR40" at 507.13,-255.28 h25
  text "H30" at 113.42,797.72 h25
  text "A21" at -240.91,1073.31 h25
  text "AR41" at 546.5,-255.28 h25
  text "H18" at -359.02,797.72 h25
  text "F28" at 34.69,876.46 h25
  text "K24" at -122.8,718.98 h25
  text "H17" at -398.39,797.72 h25
  text "G28" at 34.69,837.09 h25
  text "D19" at -319.65,955.2 h25
  text "AA41" at 546.5,295.91 h25
  text "G25" at -83.42,837.09 h25
  text "D27" at -4.68,955.2 h25
  text "BF5" at -870.83,-698.35 h25
  text "G31" at 152.79,837.09 h25
  text "AA40" at 507.13,295.91 h25
  text "K21" at -240.91,718.98 h25
  text "AR49" at 861.46,-255.28 h25
  text "A16" at -437.76,1073.31 h25
  text "BF1" at -1028.31,-698.35 h25
  text "G30" at 113.42,837.09 h25
  text "G22" at -201.53,837.09 h25
  text "A26" at -44.05,1073.31 h25
  text "AR48" at 822.09,-255.28 h25
  text "E23" at -162.16,915.83 h25
  text "BE1" at -1028.31,-658.98 h25
  text "G32" at 192.16,837.09 h25
  text "AR54" at 1058.31,-255.28 h25
  text "D20" at -280.28,955.2 h25
  text "K28" at 34.69,718.98 h25
  text "D25" at -83.42,955.2 h25
  text "B27" at -4.68,1033.94 h25
  text "BE3" at -949.57,-658.98 h25
  text "H32" at 192.16,797.72 h25
  text "AR45" at 703.98,-255.28 h25
  text "AP52" at 979.57,-215.91 h25
  text "BE4" at -910.2,-658.98 h25
  text "F31" at 152.79,876.46 h25
  text "G23" at -162.16,837.09 h25
  text "AR44" at 664.61,-255.28 h25
  text "BE5" at -870.83,-658.98 h25
  text "AN40" at 507.13,-176.53 h25
  text "D32" at 192.16,955.2 h25
  text "AP51" at 940.2,-215.91 h25
  text "AN41" at 546.5,-176.53 h25
  text "G26" at -44.05,837.09 h25
  text "BE6" at -831.46,-658.98 h25
  text "E33" at 231.53,915.83 h25
  text "H23" at -162.16,797.72 h25
  text "D24" at -122.8,955.2 h25
  text "BN11" at -634.61,-963.94 h25
  text "BF2" at -988.94,-698.35 h25
  text "D30" at 113.42,955.2 h25
  text "H24" at -122.8,797.72 h25
  text "BM27" at -4.68,-924.57 h25
  text "AR53" at 1018.94,-255.28 h25
  text "BF3" at -949.57,-698.35 h25
  text "BL28" at 34.69,-885.2 h25
  text "D31" at 152.79,955.2 h25
  text "BG2" at -988.94,-737.72 h25
  text "F29" at 74.06,876.46 h25
  text "AP46" at 743.35,-215.91 h25
  text "BN6" at -831.46,-973.94 h25
  text "AP47" at 782.72,-215.91 h25
  text "BG3" at -949.57,-737.72 h25
  text "BP7" at -792.09,-1013.31 h25
  text "F33" at 231.53,876.46 h25
  text "AN53" at 1018.94,-176.53 h25
  text "BP6" at -831.46,-1013.31 h25
  text "AN54" at 1058.31,-176.53 h25
  text "BG4" at -910.2,-737.72 h25
  text "BN7" at -792.09,-973.94 h25
  text "D29" at 74.06,955.2 h25
  text "AN44" at 664.61,-176.53 h25
  text "BN5" at -870.83,-973.94 h25
  text "AN45" at 703.98,-176.53 h25
  text "BG5" at -870.83,-737.72 h25
  text "AL40" at 507.13,-97.8 h25
  text "E29" at 74.06,915.83 h25
  text "AN49" at 861.46,-176.53 h25
  text "AL41" at 546.5,-97.8 h25
  text "AN50" at 900.83,-176.53 h25
  text "BF7" at -792.09,-698.35 h25
  text "C32" at 192.16,994.57 h25
  text "AM46" at 743.35,-137.16 h25
  text "AM47" at 782.72,-137.16 h25
  text "BF8" at -752.72,-698.35 h25
  text "A30" at 113.42,1073.31 h25
  text "AM51" at 940.2,-137.16 h25
  text "AM52" at 979.57,-137.16 h25
  text "BG7" at -792.09,-737.72 h25
  text "C29" at 74.06,994.57 h25
  text "AL44" at 664.61,-97.8 h25
  text "AL45" at 703.98,-97.8 h25
  text "BG8" at -752.72,-737.72 h25
  text "B32" at 192.16,1033.94 h25
  text "AL53" at 1018.94,-97.8 h25
  text "AL54" at 1058.31,-97.8 h25
  text "BJ7" at -792.09,-816.46 h25
  text "C28" at 34.69,994.57 h25
  text "BH7" at -792.09,-777.09 h25
  text "BM14" at -516.5,-924.57 h25
  text "A29" at 74.06,1073.31 h25
  text "BK8" at -752.72,-855.83 h25
  text "BM13" at -555.87,-924.57 h25
  text "B28" at 34.69,1033.94 h25
  text "BJ8" at -752.72,-816.46 h25
  text "BN15" at -477.13,-963.94 h25
  text "A31" at 152.79,1073.31 h25
  text "BJ6" at -831.46,-816.46 h25
  text "BP14" at -516.5,-1003.31 h25
  text "A33" at 231.53,1073.31 h25
  text "BK5" at -870.83,-855.83 h25
  text "BM15" at -477.13,-924.57 h25
  text "B30" at 113.42,1033.94 h25
  text "BH6" at -831.46,-777.09 h25
  text "BP13" at -555.87,-1003.31 h25
  text "J29" at 74.06,758.35 h25
  text "BK4" at -910.2,-855.83 h25
  text "BM12" at -595.24,-924.57 h25
  text "A28" at 34.69,1073.31 h25
  text "G12" at -595.24,837.09 h25
  text "BM8" at -752.72,-934.57 h25
  text "BN12" at -595.24,-963.94 h25
  text "D39" at 467.76,955.2 h25
  text "BK13" at -555.87,-845.83 h25
  text "BL15" at -477.13,-885.2 h25
  text "AW22" at -201.53,-412.76 h25
  text "AW20" at -280.28,-412.76 h25
  text "AY17" at -398.39,-452.13 h25
  text "AW18" at -359.02,-412.76 h25
  text "AW16" at -437.76,-412.76 h25
  text "AY19" at -319.65,-452.13 h25
  text "AY23" at -162.16,-452.13 h25
  text "BA22" at -201.53,-491.5 h25
  text "BA20" at -280.28,-491.5 h25
  text "BA18" at -359.02,-491.5 h25
  text "BA16" at -437.76,-491.5 h25
  text "BB19" at -319.65,-530.87 h25
  text "BB17" at -398.39,-530.87 h25
  text "BB23" at -162.16,-530.87 h25
  text "AY21" at -240.91,-452.13 h25
  text "BB21" at -240.91,-530.87 h25
  text "BA24" at -122.8,-491.5 h25
  text "AW24" at -122.8,-412.76 h25
  text "AY29" at 74.06,-452.13 h25
  text "AY31" at 152.79,-452.13 h25
  text "AY33" at 231.53,-452.13 h25
  text "AW28" at 34.69,-412.76 h25
  text "AW30" at 113.42,-412.76 h25
  text "AW32" at 192.16,-412.76 h25
  text "AY35" at 310.28,-452.13 h25
  text "BB29" at 74.06,-530.87 h25
  text "BB31" at 152.79,-530.87 h25
  text "BB33" at 231.53,-530.87 h25
  text "BA28" at 34.69,-491.5 h25
  text "BA30" at 113.42,-491.5 h25
  text "BA32" at 192.16,-491.5 h25
  text "BB35" at 310.28,-530.87 h25
  text "AY25" at -83.42,-452.13 h25
  text "BA34" at 270.91,-491.5 h25
  text "AW34" at 270.91,-412.76 h25
  text "BA36" at 349.65,-491.5 h25
  text "AY37" at 389.02,-452.13 h25
  text "AW36" at 349.65,-412.76 h25
  text "AW26" at -44.05,-412.76 h25
  text "AY27" at -4.68,-452.13 h25
  text "BA26" at -44.05,-491.5 h25
  text "BB25" at -83.42,-530.87 h25
  text "BB27" at -4.68,-530.87 h25
  text "AW40" at 507.13,-412.76 h25
  text "BA40" at 507.13,-491.5 h25
  text "BA38" at 428.39,-491.5 h25
  text "AY39" at 467.76,-452.13 h25
  text "AW38" at 428.39,-412.76 h25
  text "BC22" at -201.53,-570.24 h25
  text "BC20" at -280.28,-570.24 h25
  text "BC18" at -359.02,-570.24 h25
  text "BC16" at -437.76,-570.24 h25
  text "BC24" at -122.8,-570.24 h25
  text "BD19" at -319.65,-609.61 h25
  text "BD17" at -398.39,-609.61 h25
  text "BD23" at -162.16,-609.61 h25
  text "BD21" at -240.91,-609.61 h25
  text "BC28" at 34.69,-570.24 h25
  text "BC30" at 113.42,-570.24 h25
  text "BC32" at 192.16,-570.24 h25
  text "BC34" at 270.91,-570.24 h25
  text "BC36" at 349.65,-570.24 h25
  text "BB37" at 389.02,-530.87 h25
  text "BC26" at -44.05,-570.24 h25
  text "BD29" at 74.06,-609.61 h25
  text "BD31" at 152.79,-609.61 h25
  text "BD33" at 231.53,-609.61 h25
  text "BD35" at 310.28,-609.61 h25
  text "BE28" at 34.69,-648.98 h25
  text "BE30" at 113.42,-648.98 h25
  text "BD25" at -83.42,-609.61 h25
  text "BD37" at 389.02,-609.61 h25
  text "BD27" at -4.68,-609.61 h25
  text "BE26" at -44.05,-648.98 h25
  text "BC40" at 507.13,-570.24 h25
  text "BC38" at 428.39,-570.24 h25
  text "BB39" at 467.76,-530.87 h25
  text "BD39" at 467.76,-609.61 h25
  text "BF28" at 34.69,-688.35 h25
  text "BF22" at -201.53,-688.35 h25
  text "BH22" at -201.53,-767.09 h25
  text "BJ22" at -201.53,-806.46 h25
  text "BK21" at -240.91,-845.83 h25
  text "BJ27" at -4.68,-806.46 h25
  text "BH27" at -4.68,-767.09 h25
  text "BJ23" at -162.16,-806.46 h25
  text "BG22" at -201.53,-727.72 h25
  text "BJ24" at -122.8,-806.46 h25
  text "BF21" at -240.91,-688.35 h25
  text "BM23" at -162.16,-924.57 h25
  text "BM47" at 782.72,-924.57 h25
  text "BK49" at 861.46,-845.83 h25
  text "BC41" at 546.5,-570.24 h25
  text "BF30" at 113.42,-688.35 h25
  text "BE48" at 822.09,-648.98 h25
  text "L28" at 34.69,679.61 h25
  text "M35" at 310.28,640.24 h25
  text "L40" at 507.13,679.61 h25
  text "BP33" at 231.53,-1003.31 h25
  text "BG33" at 231.53,-727.72 h25
  text "BG30" at 113.42,-727.72 h25
  text "BJ49" at 861.46,-806.46 h25
  text "BK51" at 940.2,-845.83 h25
  text "BK50" at 900.83,-845.83 h25
  text "BJ32" at 192.16,-806.46 h25
  text "BK29" at 74.06,-845.83 h25
  text "BJ48" at 822.09,-806.46 h25
  text "BK48" at 822.09,-845.83 h25
  text "BM42" at 585.87,-924.57 h25
  text "BH29" at 74.06,-767.09 h25
  text "BG32" at 192.16,-727.72 h25
  text "BF33" at 231.53,-688.35 h25
  text "BH31" at 152.79,-767.09 h25
  text "BJ31" at 152.79,-806.46 h25
  text "BF32" at 192.16,-688.35 h25
  text "BH41" at 546.5,-767.09 h25
  text "L36" at 349.65,679.61 h25
  text "K39" at 467.76,718.98 h25
  text "L39" at 467.76,679.61 h25
  text "J36" at 349.65,758.35 h25
  text "K36" at 349.65,718.98 h25
  text "K38" at 428.39,718.98 h25
  text "L38" at 428.39,679.61 h25
  text "L34" at 270.91,679.61 h25
  text "H39" at 467.76,797.72 h25
  text "J39" at 467.76,758.35 h25
  text "H28" at 34.69,797.72 h25
  text "C33" at 231.53,994.57 h25
  text "B33" at 231.53,1033.94 h25
  text "BL11" at -634.61,-885.2 h25
  text "BH12" at -595.24,-767.09 h25
  text "A13" at -555.87,1073.31 h25
  text "G15" at -477.13,837.09 h25
  text "H9" at -713.35,787.72 h25
  text "C14" at -516.5,994.57 h25
  text "C13" at -555.87,994.57 h25
  text "BN35" at 310.28,-963.94 h25
  text "AB28" at 34.69,256.54 h25
  text "L15" at -477.13,679.61 h25
  text "BE8" at -752.72,-658.98 h25
  text "BG14" at -516.5,-727.72 h25
  text "F19" at -319.65,876.46 h25
  text "F20" at -280.28,876.46 h25
  text "BL23" at -162.16,-885.2 h25
  text "BJ21" at -240.91,-806.46 h25
  text "BK26" at -44.05,-845.83 h25
  text "BL25" at -83.42,-885.2 h25
Mechanical56:
  text "IRONWOOD SOCKET # C17263 OR C13883" at -981.01,5844.69 h63
  text "SYMBOL NAME: SOC_2892_1MM_IRONWOOD" at -977.01,5612.69 h63
  text "PADSTACKS: C20, C86NH87, C35NH35" at -980.01,5410.69 h63
  text "PKG HEIGHT: 1032 MILS" at -983.01,5962.69 h63
  text "DIMENSIONS: MILS (MM)" at -977.01,5762.69 h63
  text "Created By: CAROL 4-21-18" at -977.01,5685.69 h63
  text "Checked By: GREG  4-23-18" at -982.01,5521.69 h63
Mechanical61:
  lines w1: -1180.87,-1181.1 1181.34,1181.1 ; -1180.87,1181.1 1181.34,-1181.1
Mechanical255:
  lines w1: -1135,-1150 -1134,1150 1165,1150 1165,-1150 -1135,-1150